# Altium schematic symbol library Connectors_Misc.SchLib: 48 symbols (part 1 of 2)
Pins are listed as number, name and electrical type; pins without a type are passive.

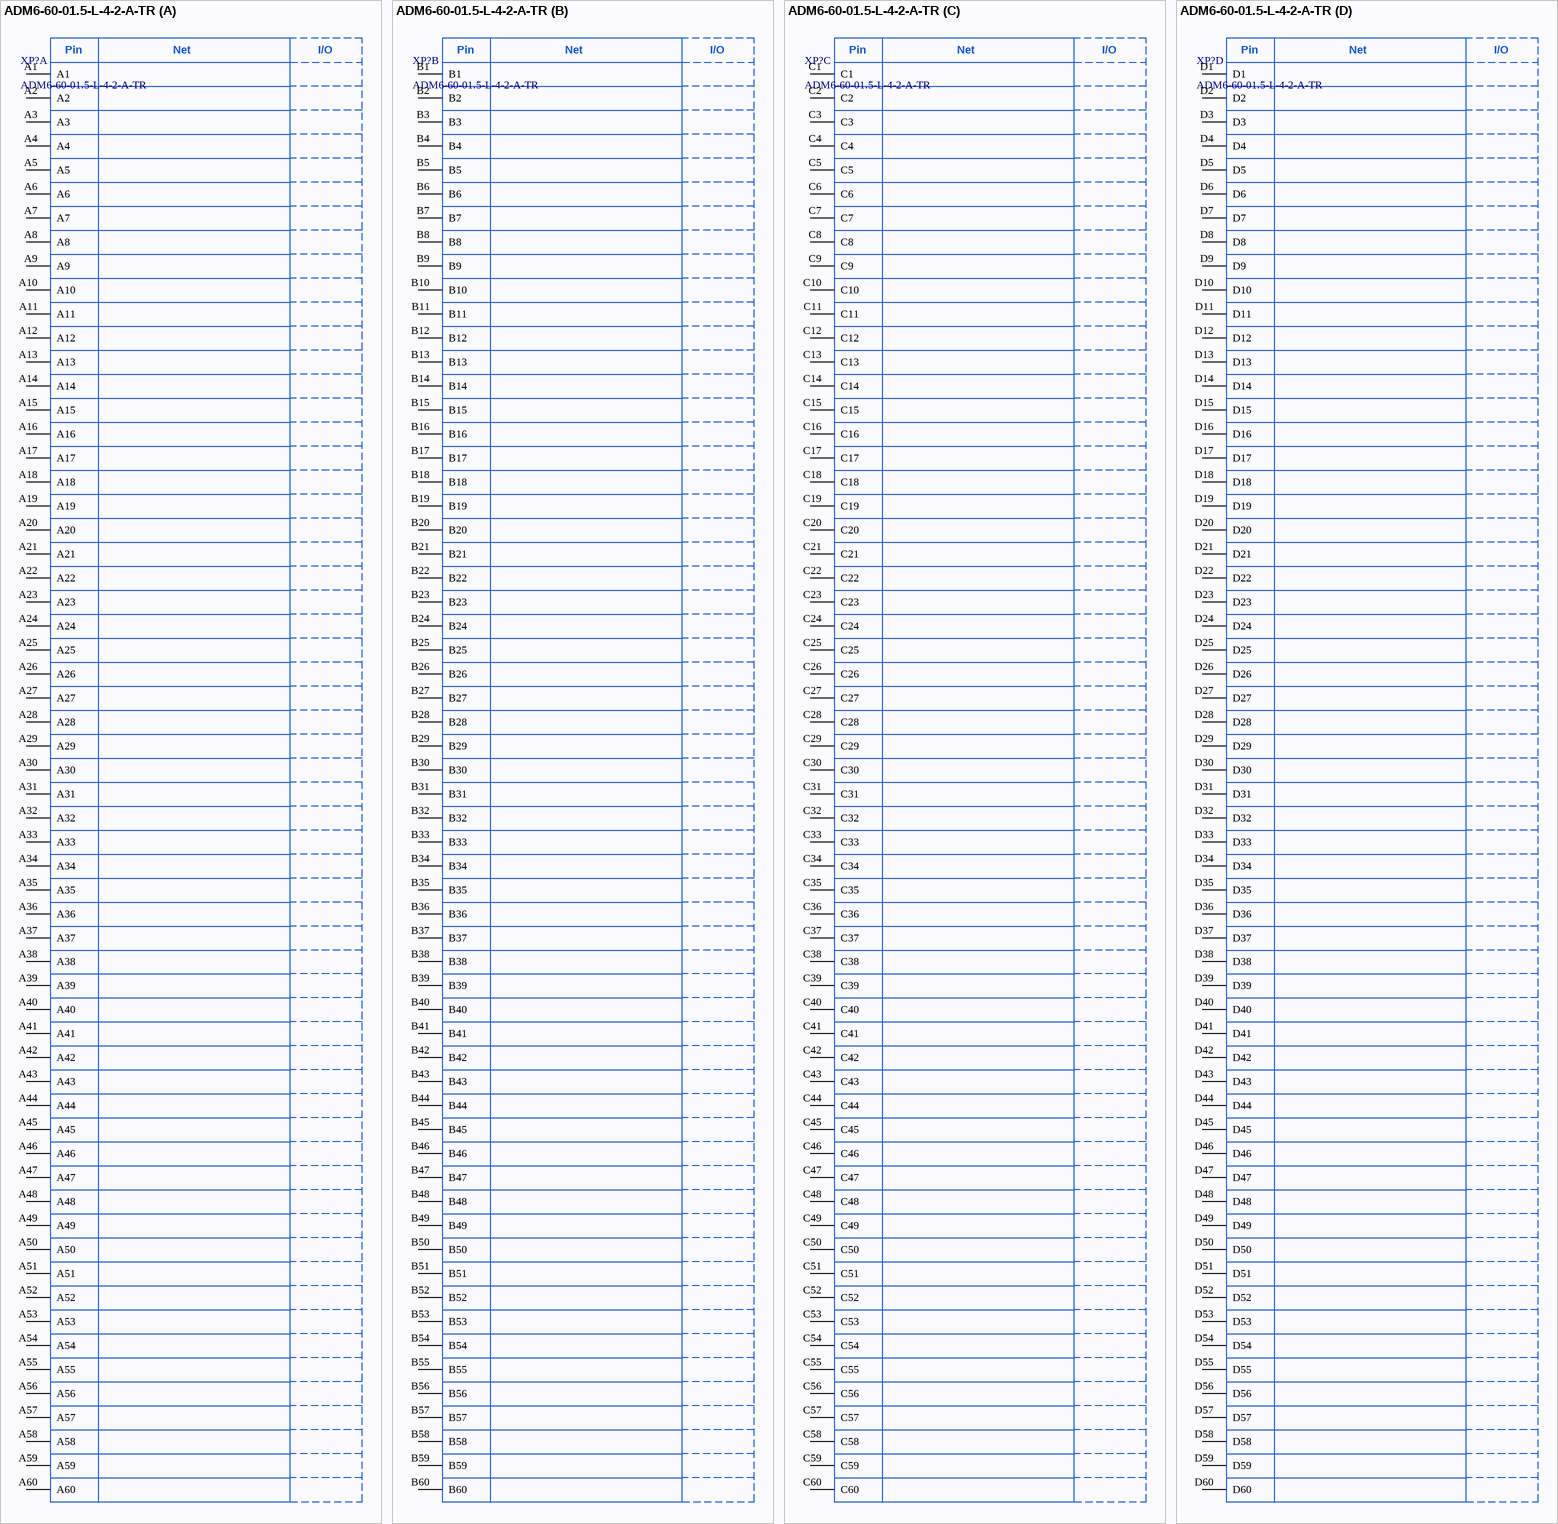
[diagram p0: symbol ADM6-60-01.5-L-4-2-A-TR]

## ADM6-60-01.5-L-4-2-A-TR
designator XP?
0.635 mm AcceleRate HD High-Density 4-Row Terminal; Manufacturer: Samtec; ItemType: Connector; PartNumber: ADM6-60-01.5-L-4-2-A-TR; ItemSubType: AcceleRate; Mounting: SMD
footprint ADM6-60-01.5-L-4-2-A-TR (0.635 mm AcceleRate HD High-Density 4-Row Terminal)
part A pins: A1, A2, A3, A4, A5, A6, A7, A8, A9, A10, A11, A12, A13, A14, A15, A16, A17, A18, A19, A20, A21, A22, A23, A24, A25, A26, A27, A28, A29, A30, A31, A32, A33, A34, A35, A36, A37, A38, A39, A40, A41, A42, A43, A44, A45, A46, A47, A48, A49, A50, A51, A52, A53, A54, A55, A56, A57, A58, A59, A60
part B pins: B1, B2, B3, B4, B5, B6, B7, B8, B9, B10, B11, B12, B13, B14, B15, B16, B17, B18, B19, B20, B21, B22, B23, B24, B25, B26, B27, B28, B29, B30, B31, B32, B33, B34, B35, B36, B37, B38, B39, B40, B41, B42, B43, B44, B45, B46, B47, B48, B49, B50, B51, B52, B53, B54, B55, B56, B57, B58, B59, B60
part C pins: C1, C2, C3, C4, C5, C6, C7, C8, C9, C10, C11, C12, C13, C14, C15, C16, C17, C18, C19, C20, C21, C22, C23, C24, C25, C26, C27, C28, C29, C30, C31, C32, C33, C34, C35, C36, C37, C38, C39, C40, C41, C42, C43, C44, C45, C46, C47, C48, C49, C50, C51, C52, C53, C54, C55, C56, C57, C58, C59, C60
part D pins: D1, D2, D3, D4, D5, D6, D7, D8, D9, D10, D11, D12, D13, D14, D15, D16, D17, D18, D19, D20, D21, D22, D23, D24, D25, D26, D27, D28, D29, D30, D31, D32, D33, D34, D35, D36, D37, D38, D39, D40, D41, D42, D43, D44, D45, D46, D47, D48, D49, D50, D51, D52, D53, D54, D55, D56, D57, D58, D59, D60
part A text: Pin; Net; I/O
part B text: Pin; Net; I/O
part C text: Pin; Net; I/O
part D text: Pin; Net; I/O

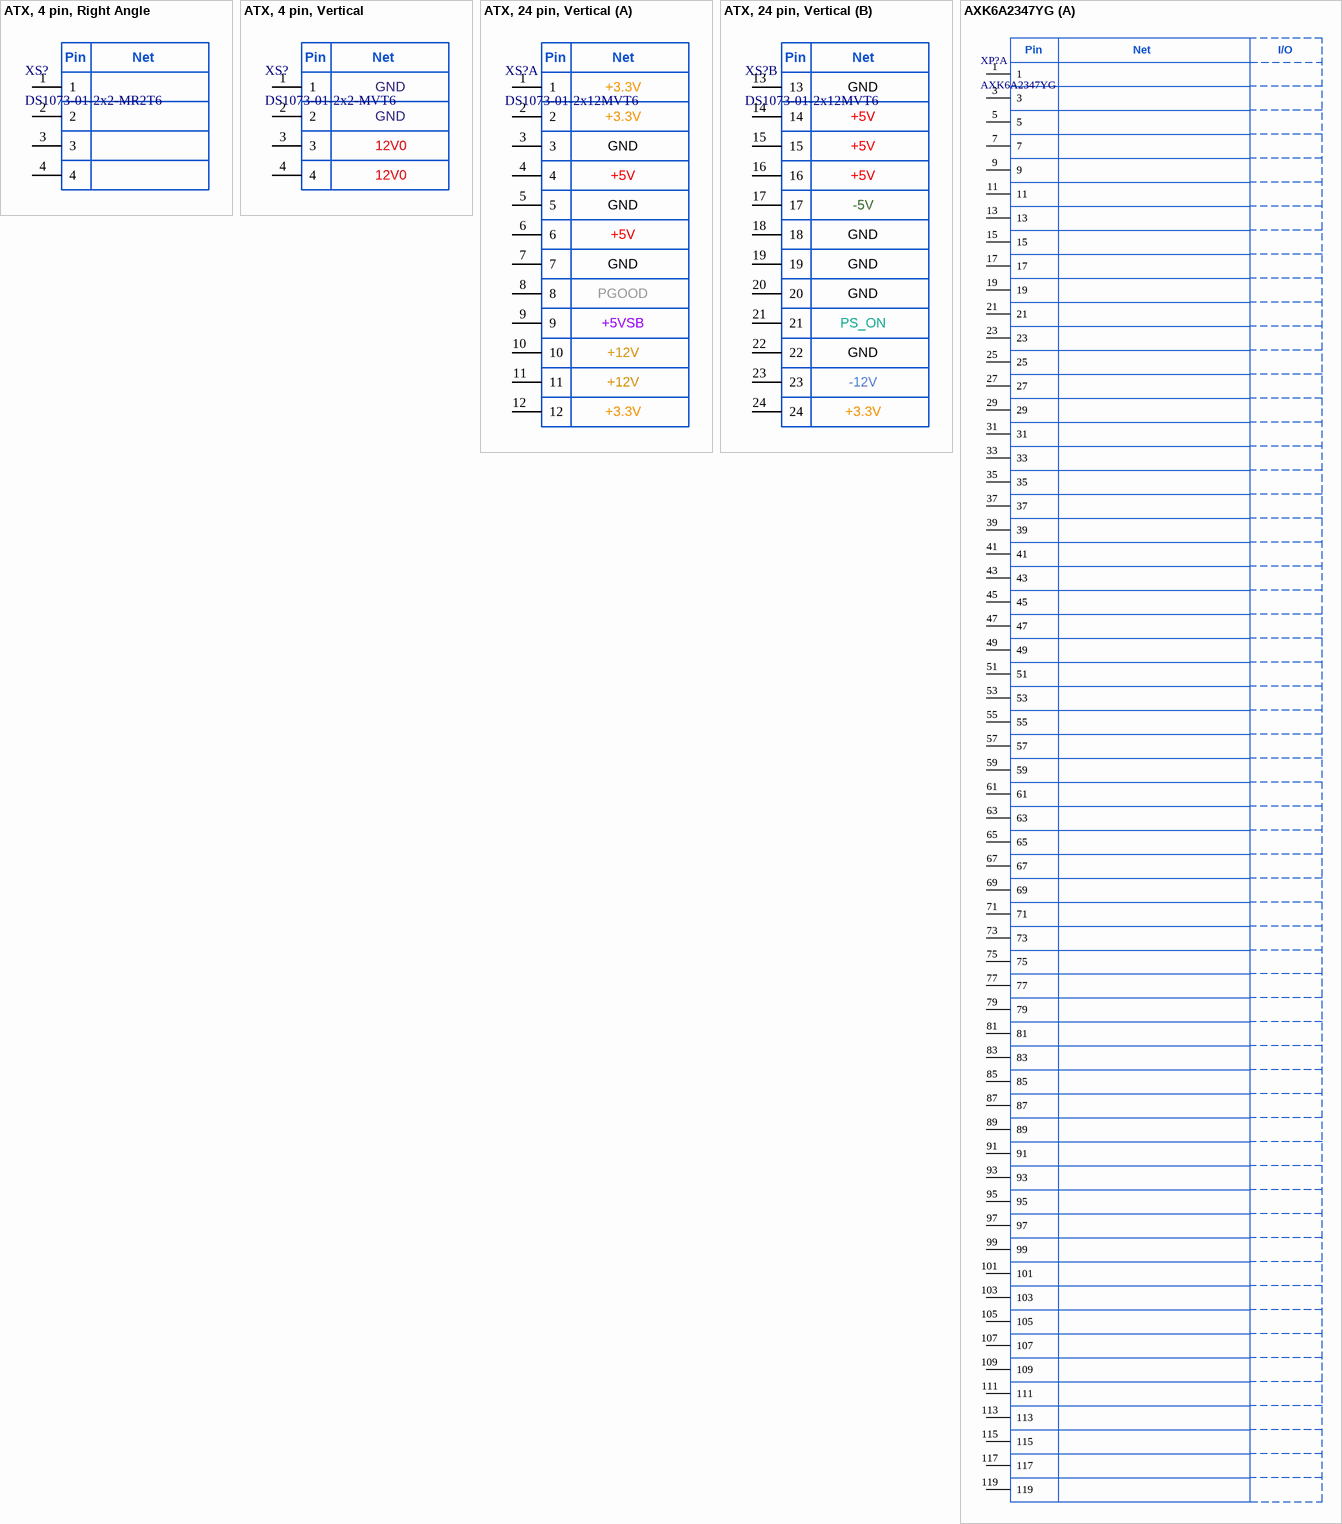
[diagram p1: symbols ATX, 4 pin, Right Angle to AXK6A2347YG]

## ATX, 4 pin, Right Angle
designator XS?, comment DS1073-01-2x2-MR2T6
ATX 4 pin right angle; Manufacturer: Connfly; ItemType: Connector; ItemSubType: ATX R/A; PartNumber: DS1073-01-2x2-MR2T6; Mounting: THT
footprint DS1073-01-2x2-MR2T6
pins: 1, 2, 3, 4
text: Pin; Net

## ATX, 4 pin, Vertical
designator XS?, comment DS1073-01-2x2-MVT6
ATX 4 pin; Manufacturer: Connfly; AltManufacturer1: KLS; ItemType: Connector; ItemSubType: ATX V/T; Alternative1: L-KLS1-4.20-2X02-SB; PartNumber: DS1073-01-2x2-MVT6; Mounting: THT
footprint DS1073-01-2x2-MVT6
pins: 1, 2, 3, 4
text: Pin; Net; GND; 12V0

## ATX, 24 pin, Vertical
designator XS?, comment DS1073-01-2x12MVT6
ATX 24 pin; Manufacturer: Connfly; ItemType: Connector; ItemSubType: ATX V/T; PartNumber: DS1073-01-2x12MVT6; Mounting: THT
footprint DS1073-01-2x12MVT6 (ATX24)
part A pins: 1, 2, 3, 4, 5, 6, 7, 8, 9, 10, 11, 12
part B pins: 13, 14, 15, 16, 17, 18, 19, 20, 21, 22, 23, 24
part A text: Pin; Net; +3.3V; GND; +5V; PGOOD; +5VSB; +12V
part B text: Pin; Net; GND; +5V; -5V; PS_ON; -12V; +3.3V

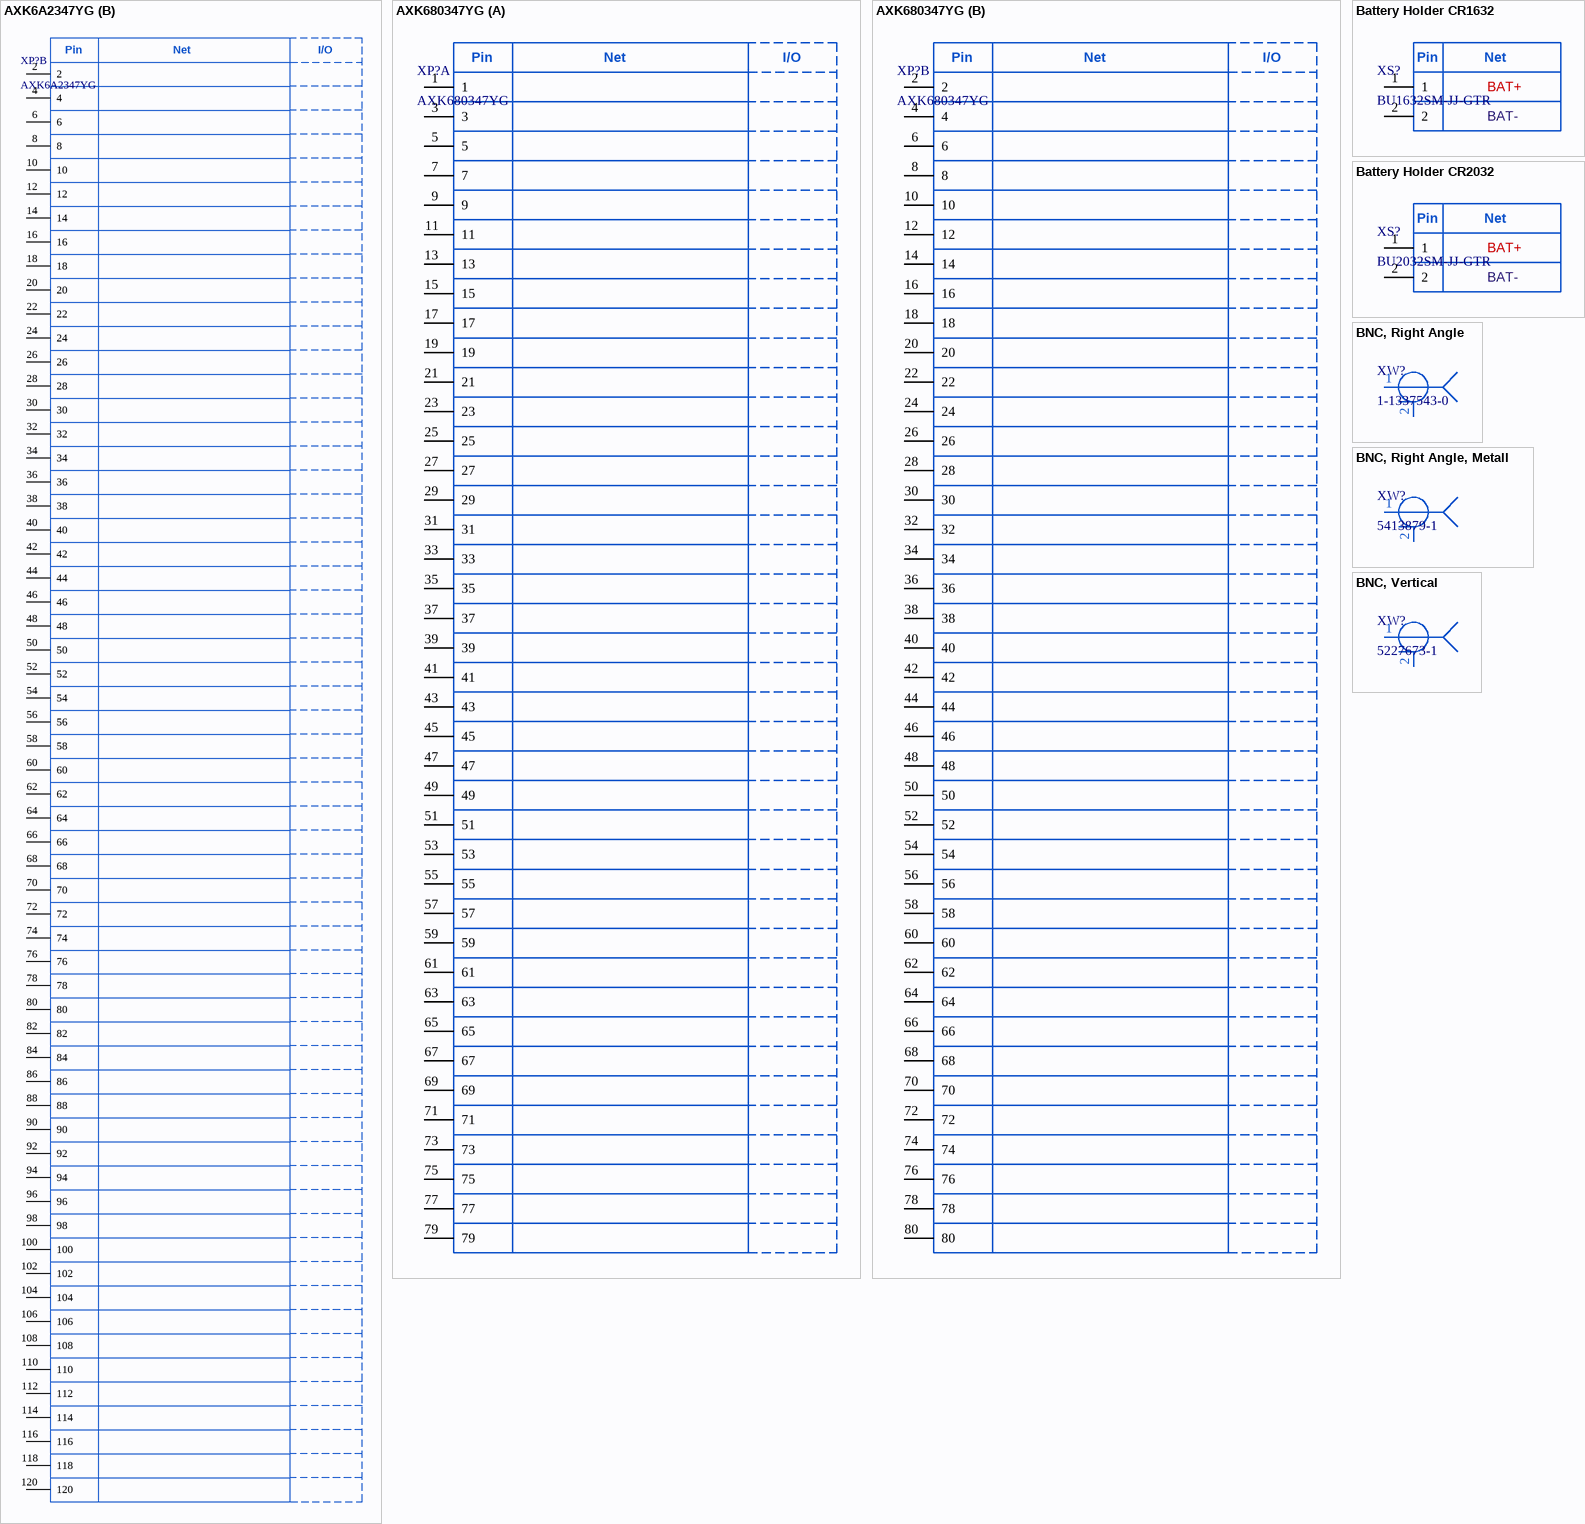
[diagram p2: symbols AXK6A2347YG to BNC, Vertical]

## AXK6A2347YG
designator XP?
0.5mm Pitch, 120-pin High-Speed connector for Board-to-Board connection, H = 3.0mm; Manufacturer: Panasonic; ItemSubType: P5K Series; PartNumber: AXK6A2347YG; ItemType: Connector; Mounting: SMD
footprint AXK6A2347YG (Header 120 pin)
part A pins: 1, 3, 5, 7, 9, 11, 13, 15, 17, 19, 21, 23, 25, 27, 29, 31, 33, 35, 37, 39, 41, 43, 45, 47, 49, 51, 53, 55, 57, 59, 61, 63, 65, 67, 69, 71, 73, 75, 77, 79, 81, 83, 85, 87, 89, 91, 93, 95, 97, 99, 101, 103, 105, 107, 109, 111, 113, 115, 117, 119
part B pins: 2, 4, 6, 8, 10, 12, 14, 16, 18, 20, 22, 24, 26, 28, 30, 32, 34, 36, 38, 40, 42, 44, 46, 48, 50, 52, 54, 56, 58, 60, 62, 64, 66, 68, 70, 72, 74, 76, 78, 80, 82, 84, 86, 88, 90, 92, 94, 96, 98, 100, 102, 104, 106, 108, 110, 112, 114, 116, 118, 120
part A text: Pin; Net; I/O
part B text: Pin; Net; I/O

## AXK680347YG
designator XP?
0.5mm Pitch, 80-pin High-Speed connector for Board-to-Board connection, H = 3.0mm; Manufacturer: Panasonic; ItemSubType: P5K Series; PartNumber: AXK680347YG; ItemType: Connector; Mounting: SMD
footprint AXK680347YG (Header 80 pin)
part A pins: 1, 3, 5, 7, 9, 11, 13, 15, 17, 19, 21, 23, 25, 27, 29, 31, 33, 35, 37, 39, 41, 43, 45, 47, 49, 51, 53, 55, 57, 59, 61, 63, 65, 67, 69, 71, 73, 75, 77, 79
part B pins: 2, 4, 6, 8, 10, 12, 14, 16, 18, 20, 22, 24, 26, 28, 30, 32, 34, 36, 38, 40, 42, 44, 46, 48, 50, 52, 54, 56, 58, 60, 62, 64, 66, 68, 70, 72, 74, 76, 78, 80
part A text: Pin; Net; I/O
part B text: Pin; Net; I/O

## Battery Holder CR1632
designator XS?, comment BU1632SM-JJ-GTR
CR1632 Holder; Manufacturer: Memory Protection Devices; ItemType: Connector; PartNumber: BU1632SM-JJ-GTR; ItemSubType: Holder; Mounting: SMD
footprint BU1632SM (CR1632 Holder)
pins: 1, 2
text: Pin; Net; BAT+; BAT-

## Battery Holder CR2032
designator XS?, comment BU2032SM-JJ-GTR
CR2032 Holder; Manufacturer: Memory Protection Devices; ItemType: Connector; PartNumber: BU2032SM-JJ-GTR; ItemSubType: Holder; Mounting: SMD
footprint BU2032SM (CR0232 Holder)
pins: 1, 2
text: Pin; Net; BAT+; BAT-

## BNC, Right Angle
designator XW?, comment 1-1337543-0
BNC R/A Socket; Manufacturer: TE-Connectivity; Impedance: 50; ItemType: Connector; PartNumber: 1-1337543-0; ItemSubType: BNC; Mounting: THT
footprint 1-1337543-0 (BNC Connector)
pins: 1, 2

## BNC, Right Angle, Metall
designator XW?, comment 5413879-1
BNC R/A Socket; Manufacturer: TE-Connectivity; Impedance: 50; ItemType: Connector; PartNumber: 5413879-1; ItemSubType: BNC; Mounting: THT
footprint 5413879-1 (BNC Connector)
pins: 1, 2

## BNC, Vertical
designator XW?, comment 5227673-1
BNC Vertical Socket; Manufacturer: TE-Connectivity; Impedance: 50; ItemType: Connector; PartNumber: 5227673-1; ItemSubType: BNC; Mounting: THT
footprint 5227673-1 (BNC Connector)
pins: 1, 2

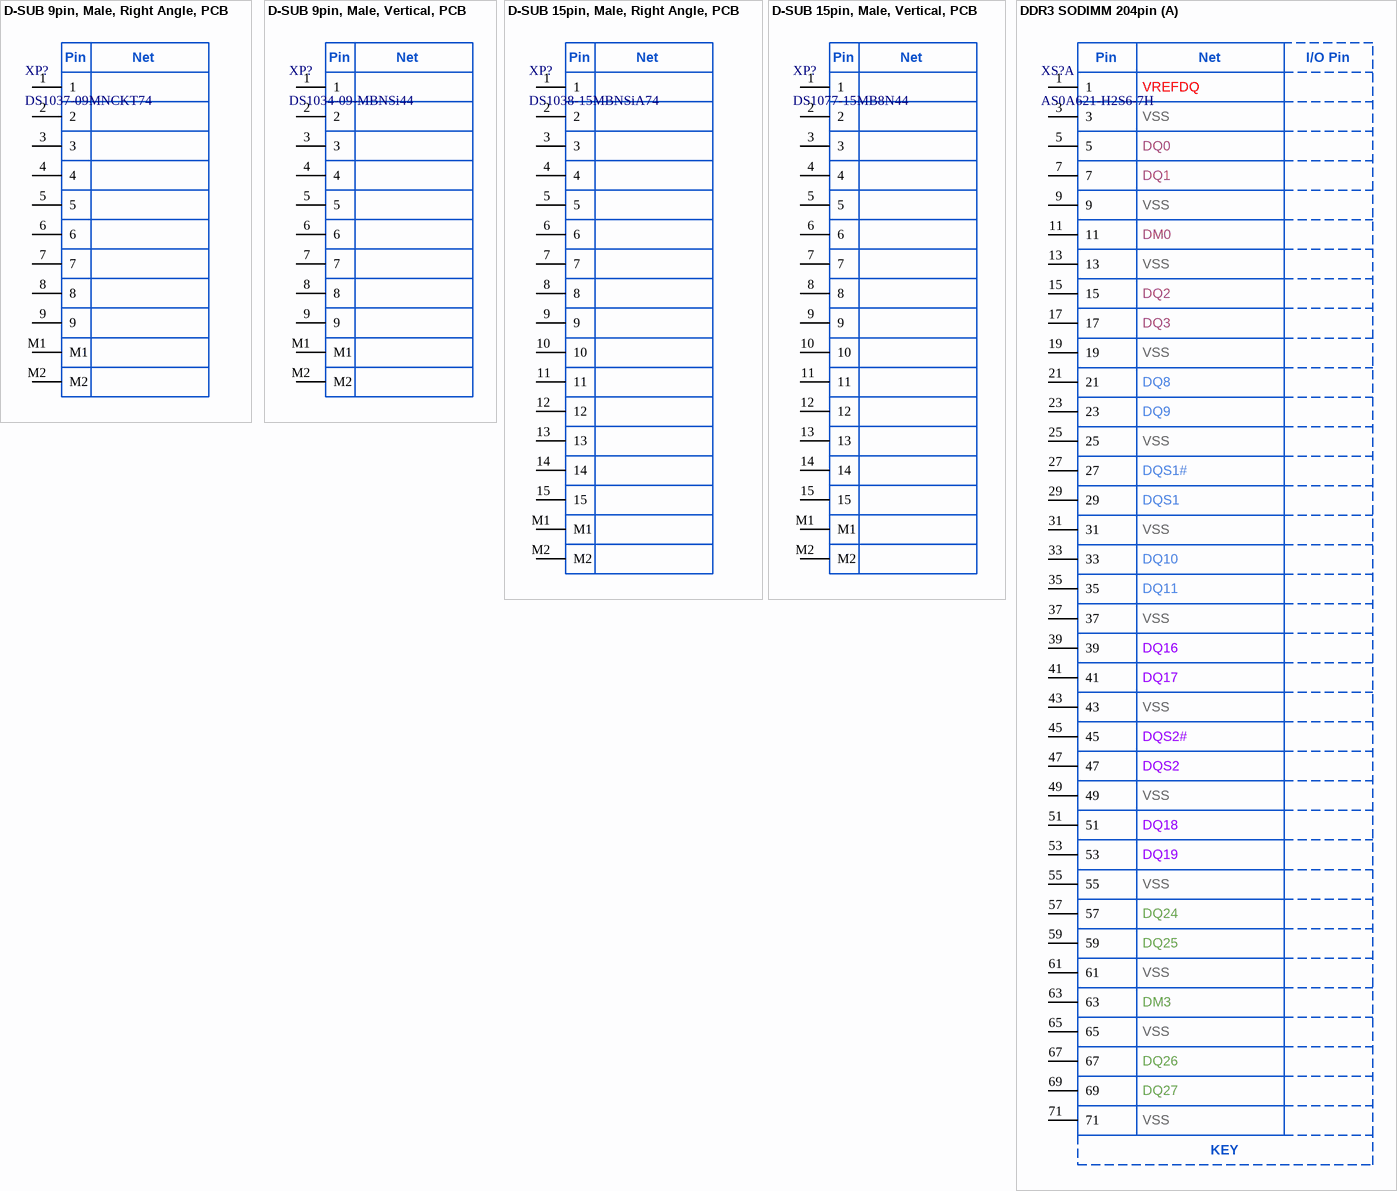
[diagram p3: symbols D-SUB 9pin, Male, Right Angle, PCB to DDR3 SODIMM 204pin]

## D-SUB 9pin, Male, Right Angle, PCB
designator XP?, comment DS1037-09MNCKT74
D-SUB 9pin, Male, Right Angle, PCB; Manufacturer: Connfly; ItemType: Connector; PartNumber: DS1037-09MNCKT74; ItemSubType: D-SUB; Mounting: THT
footprint DS1037-09MNCKT74 (D-SUB 9 pin with screw, right angle, 7.2mm)
pins: 1, 2, 3, 4, 5, 6, 7, 8, 9, M1, M2
text: Pin; Net

## D-SUB 9pin, Male, Vertical, PCB
designator XP?, comment DS1034-09-MBNSi44
D-SUB 9pin, Male, Vertical, PCB; Manufacturer: Connfly; ItemType: Connector; PartNumber: DS1034-09-MBNSi44; ItemSubType: D-SUB; Mounting: THT
footprint DS1034-09-MBNSi44 (D-SUB 9 pin with screw)
pins: 1, 2, 3, 4, 5, 6, 7, 8, 9, M1, M2
text: Pin; Net

## D-SUB 15pin, Male, Right Angle, PCB
designator XP?, comment DS1038-15MBNSiA74
D-SUB 15pin, Male, Right Angle, PCB, 3 row; Manufacturer: Connfly; ItemType: Connector; PartNumber: DS1038-15MBNSiA74; ItemSubType: D-SUB; Mounting: THT
footprint DS1038-15MBNSiA74 (D-SUB 15 pin with screw, right angle, 7.2mm)
pins: 1, 2, 3, 4, 5, 6, 7, 8, 9, 10, 11, 12, 13, 14, 15, M1, M2
text: Pin; Net

## D-SUB 15pin, Male, Vertical, PCB
designator XP?, comment DS1077-15MB8N44
D-SUB 15pin, Male, Vertical, PCB; Manufacturer: Connfly; ItemType: Connector; PartNumber: DS1077-15MB8N44; ItemSubType: D-SUB; Mounting: THT
footprint DS1077-15MB8N44 (D-SUB 15 pin with screw)
pins: 1, 2, 3, 4, 5, 6, 7, 8, 9, 10, 11, 12, 13, 14, 15, M1, M2
text: Pin; Net

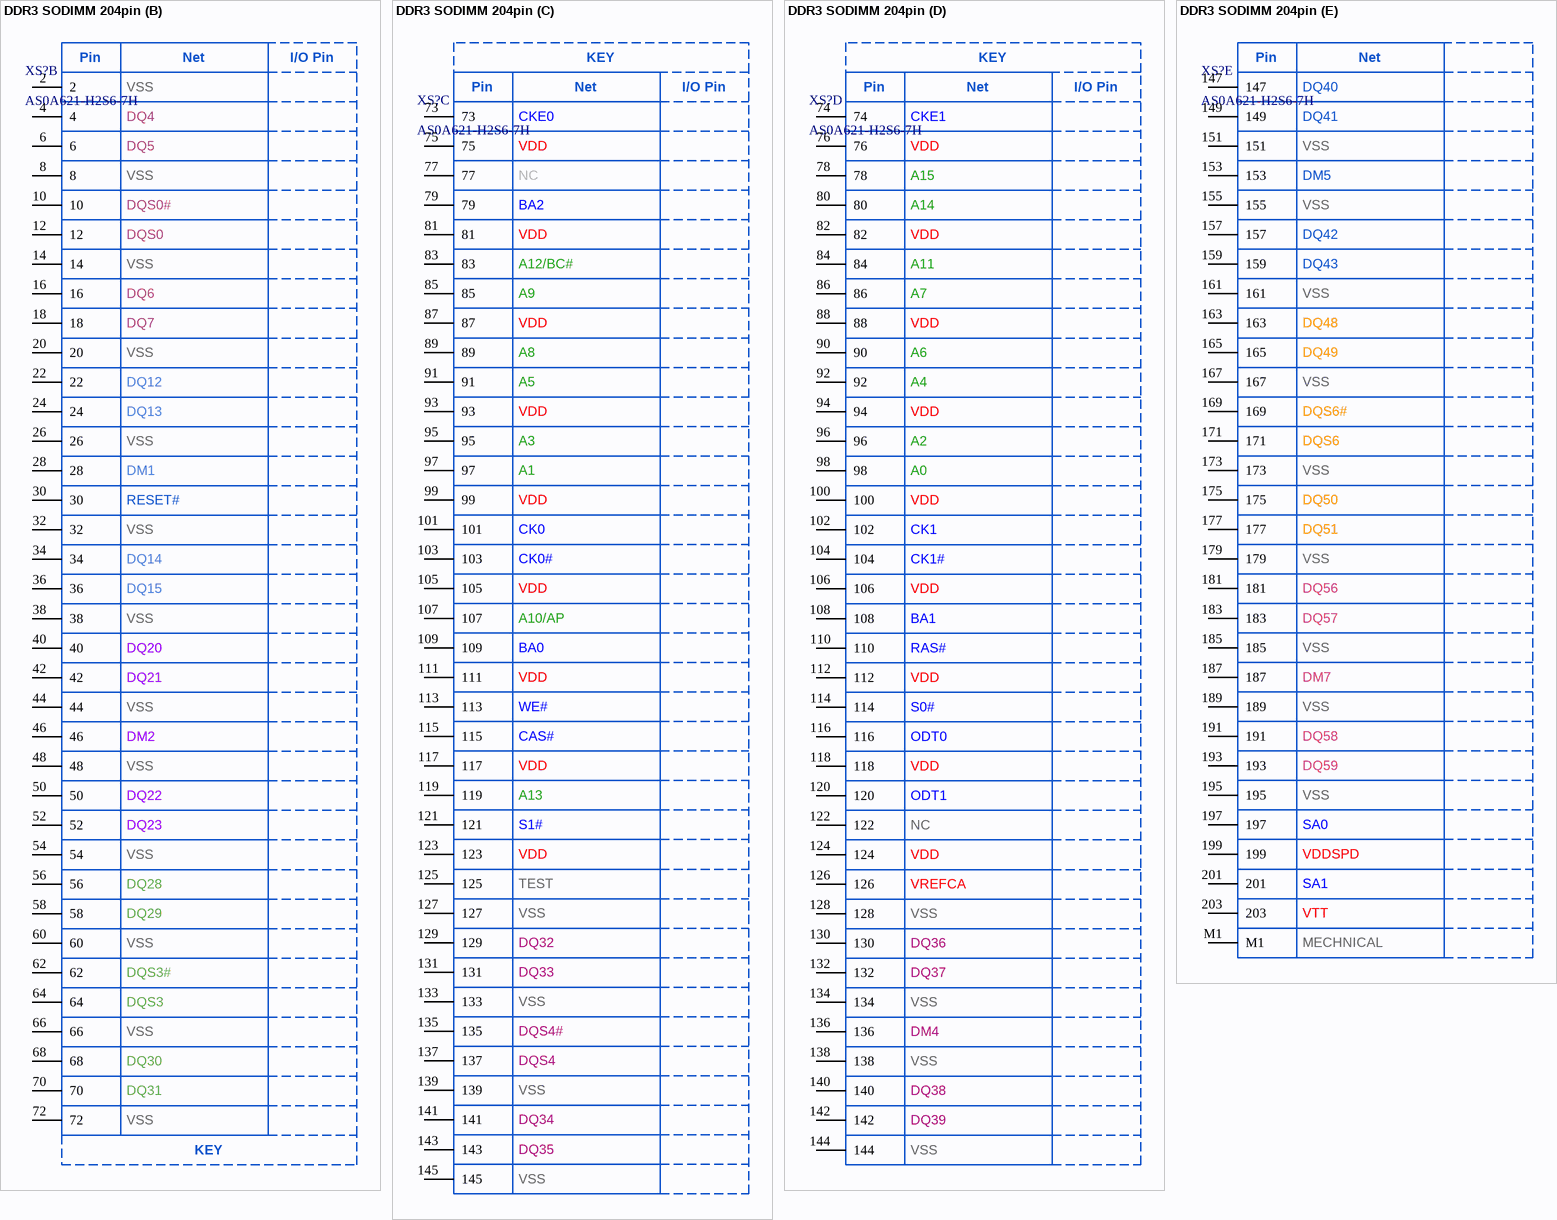
[diagram p4: symbol DDR3 SODIMM 204pin]

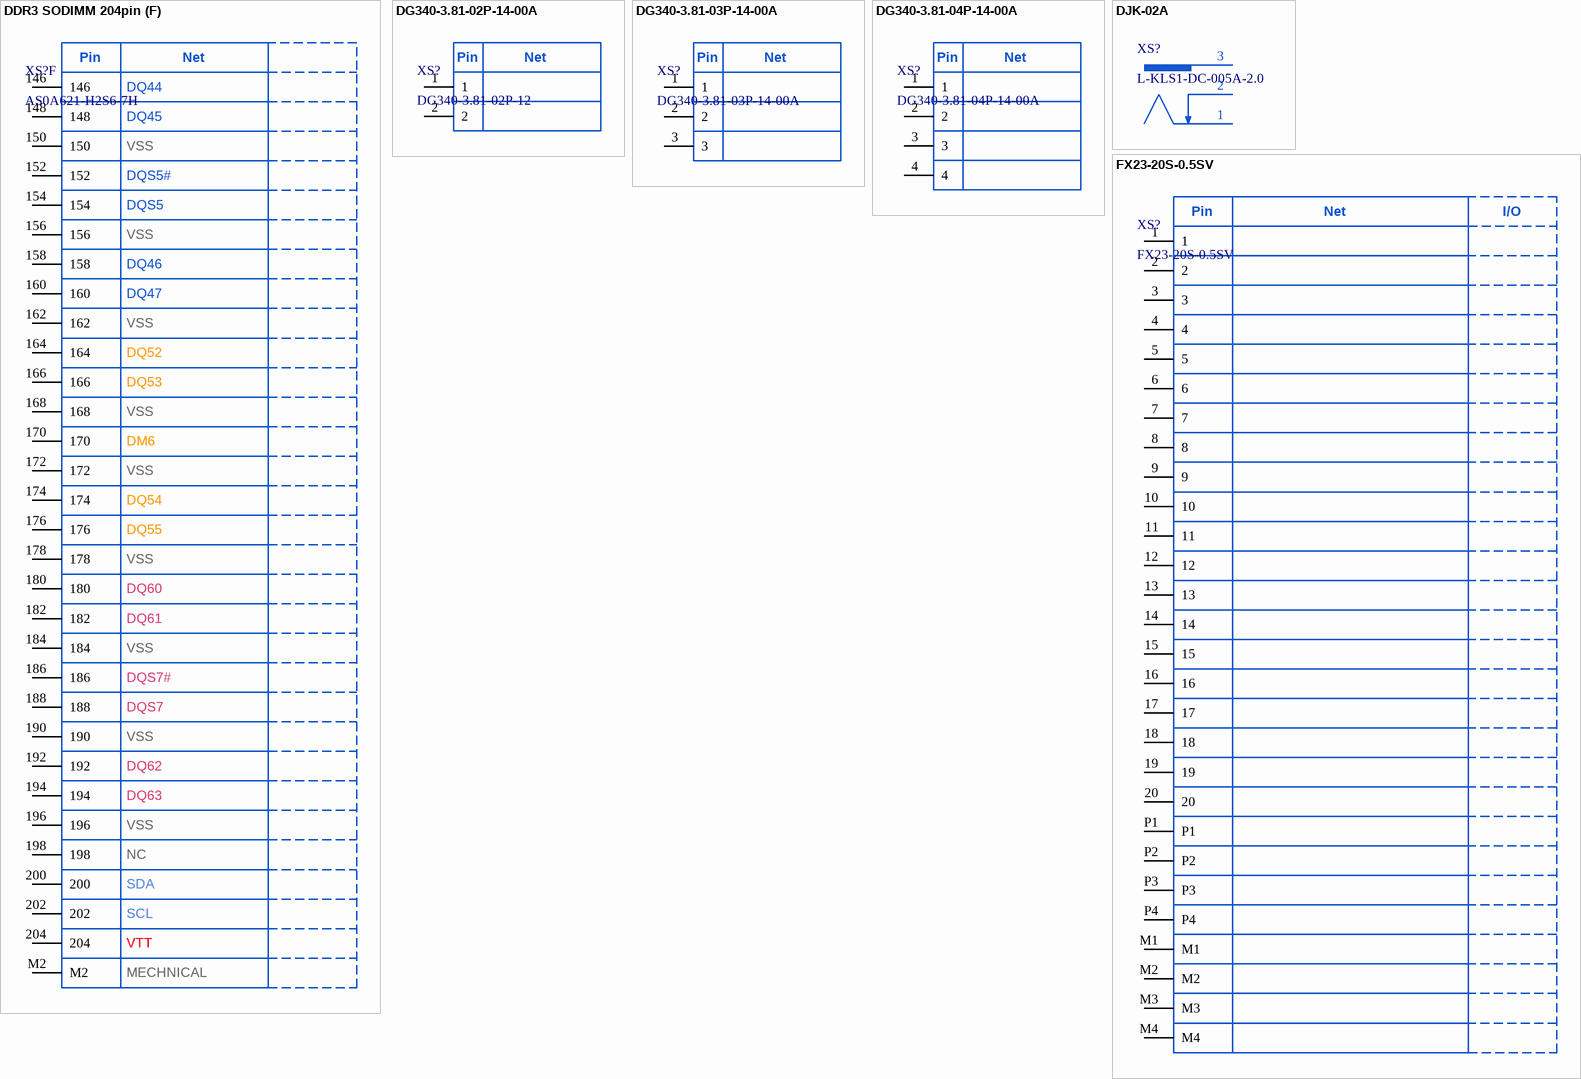
[diagram p5: symbols DDR3 SODIMM 204pin to FX23-20S-0.5SV]

## DDR3 SODIMM 204pin
designator XS?, comment AS0A621-H2S6-7H
204-pin SO DIMM DDR3 Socket; Manufacturer: Foxconn; ItemType: Connector; ItemSubType: SODIMM; PartNumber: AS0A621-H2S6-7H; Mounting: SMD
footprint AS0A621-H2S6-7H (204-pin SO DIMM DDR3 Socket)
part A pins: 1, 3, 5, 7, 9, 11, 13, 15, 17, 19, 21, 23, 25, 27, 29, 31, 33, 35, 37, 39, 41, 43, 45, 47, 49, 51, 53, 55, 57, 59, 61, 63, 65, 67, 69, 71
part B pins: 2, 4, 6, 8, 10, 12, 14, 16, 18, 20, 22, 24, 26, 28, 30, 32, 34, 36, 38, 40, 42, 44, 46, 48, 50, 52, 54, 56, 58, 60, 62, 64, 66, 68, 70, 72
part C pins: 73, 75, 77, 79, 81, 83, 85, 87, 89, 91, 93, 95, 97, 99, 101, 103, 105, 107, 109, 111, 113, 115, 117, 119, 121, 123, 125, 127, 129, 131, 133, 135, 137, 139, 141, 143, 145
part D pins: 74, 76, 78, 80, 82, 84, 86, 88, 90, 92, 94, 96, 98, 100, 102, 104, 106, 108, 110, 112, 114, 116, 118, 120, 122, 124, 126, 128, 130, 132, 134, 136, 138, 140, 142, 144
part E pins: 147, 149, 151, 153, 155, 157, 159, 161, 163, 165, 167, 169, 171, 173, 175, 177, 179, 181, 183, 185, 187, 189, 191, 193, 195, 197, 199, 201, 203, M1
part F pins: 146, 148, 150, 152, 154, 156, 158, 160, 162, 164, 166, 168, 170, 172, 174, 176, 178, 180, 182, 184, 186, 188, 190, 192, 194, 196, 198, 200, 202, 204, M2
part A text: Pin; Net; I/O Pin; VREFDQ; VSS; DQ0; DQ1; DM0; DQ2; DQ3; DQ8; DQ9; DQS1#; DQS1; DQ10; DQ11; DQ16; DQ17; DQS2#; DQS2; DQ18; DQ19; DQ24; DQ25; DM3; DQ26; DQ27; KEY
part B text: Pin; Net; I/O Pin; VSS; DQ4; DQ5; DQS0#; DQS0; DQ6; DQ7; DQ12; DQ13; DM1; RESET#; DQ14; DQ15; DQ20; DQ21; DM2; DQ22; DQ23; DQ28; DQ29; DQS3#; DQS3; DQ30; DQ31; KEY
part C text: KEY; Pin; Net; I/O Pin; CKE0; VDD; NC; BA2; A12/BC#; A9; A8; A5; A3; A1; CK0; CK0#; A10/AP; BA0; WE#; CAS#; A13; S1#; TEST; VSS; DQ32; DQ33; DQS4#; DQS4; DQ34; DQ35
part D text: KEY; Pin; Net; I/O Pin; CKE1; VDD; A15; A14; A11; A7; A6; A4; A2; A0; CK1; CK1#; BA1; RAS#; S0#; ODT0; ODT1; NC; VREFCA; VSS; DQ36; DQ37; DM4; DQ38; DQ39
part E text: Pin; Net; DQ40; DQ41; VSS; DM5; DQ42; DQ43; DQ48; DQ49; DQS6#; DQS6; DQ50; DQ51; DQ56; DQ57; DM7; DQ58; DQ59; SA0; VDDSPD; SA1; VTT; MECHNICAL
part F text: Pin; Net; DQ44; DQ45; VSS; DQS5#; DQS5; DQ46; DQ47; DQ52; DQ53; DM6; DQ54; DQ55; DQ60; DQ61; DQS7#; DQS7; DQ62; DQ63; NC; SDA; SCL; VTT; MECHNICAL

## DG340-3.81-02P-14-00A
designator XS?, comment DG340-3.81-02P-12
2-way screw terminal, pitch 150mils (3.81mm); Manufacturer: DEGSON; ItemType: Connector; PartNumber: DG340-3.81-02P-12; ItemSubType: Screw Terminal; Mounting: THT
footprint DG340-3.81-02P (2-way screw terminal, pitch 150mils (3.81mm))
pins: 1, 2
text: Pin; Net

## DG340-3.81-03P-14-00A
designator XS?
3-way screw terminal, pitch 150mils (3.81mm); Manufacturer: DEGSON; ItemType: Connector; PartNumber: DG340-3.81-03P-14-00A; ItemSubType: Screw Terminal; Mounting: THT
footprint DG340-3.81-03P (3-way screw terminal, pitch 150mils (3.81mm))
pins: 1, 2, 3
text: Pin; Net

## DG340-3.81-04P-14-00A
designator XS?
4-way screw terminal, pitch 150mils (3.81mm); Manufacturer: DEGSON; ItemType: Connector; PartNumber: DG340-3.81-04P-14-00A; ItemSubType: Screw Terminal; Mounting: THT
footprint DG340-3.81-04P (4-way screw terminal, pitch 150mils (3.81mm))
pins: 1, 2, 3, 4
text: Pin; Net

## DJK-02A
designator XS?, comment L-KLS1-DC-005A-2.0
DC Jack Connector 2.0 х 9 mm; Manufacturer: KLS; ItemSubType: Power Jack; PartNumber: L-KLS1-DC-005A-2.0; ItemType: Connector; Mounting: THT
footprint DJK-02A
pins: 1, 2, 3

## FX23-20S-0.5SV
designator XS?
0.5mm Pitch, 20-pin High-Speed Socket Board-to-Board Floating Connectors; Manufacturer: Hirose; ItemSubType: FX23; PartNumber: FX23-20S-0.5SV; ItemType: Connector; Mounting: SMD
footprint FX23-20S-0.5SV (Socket 20 pin)
pins: 1, 2, 3, 4, 5, 6, 7, 8, 9, 10, 11, 12, 13, 14, 15, 16, 17, 18, 19, 20, M1, M2, M3, M4, P1, P2, P3, P4
text: Pin; Net; I/O

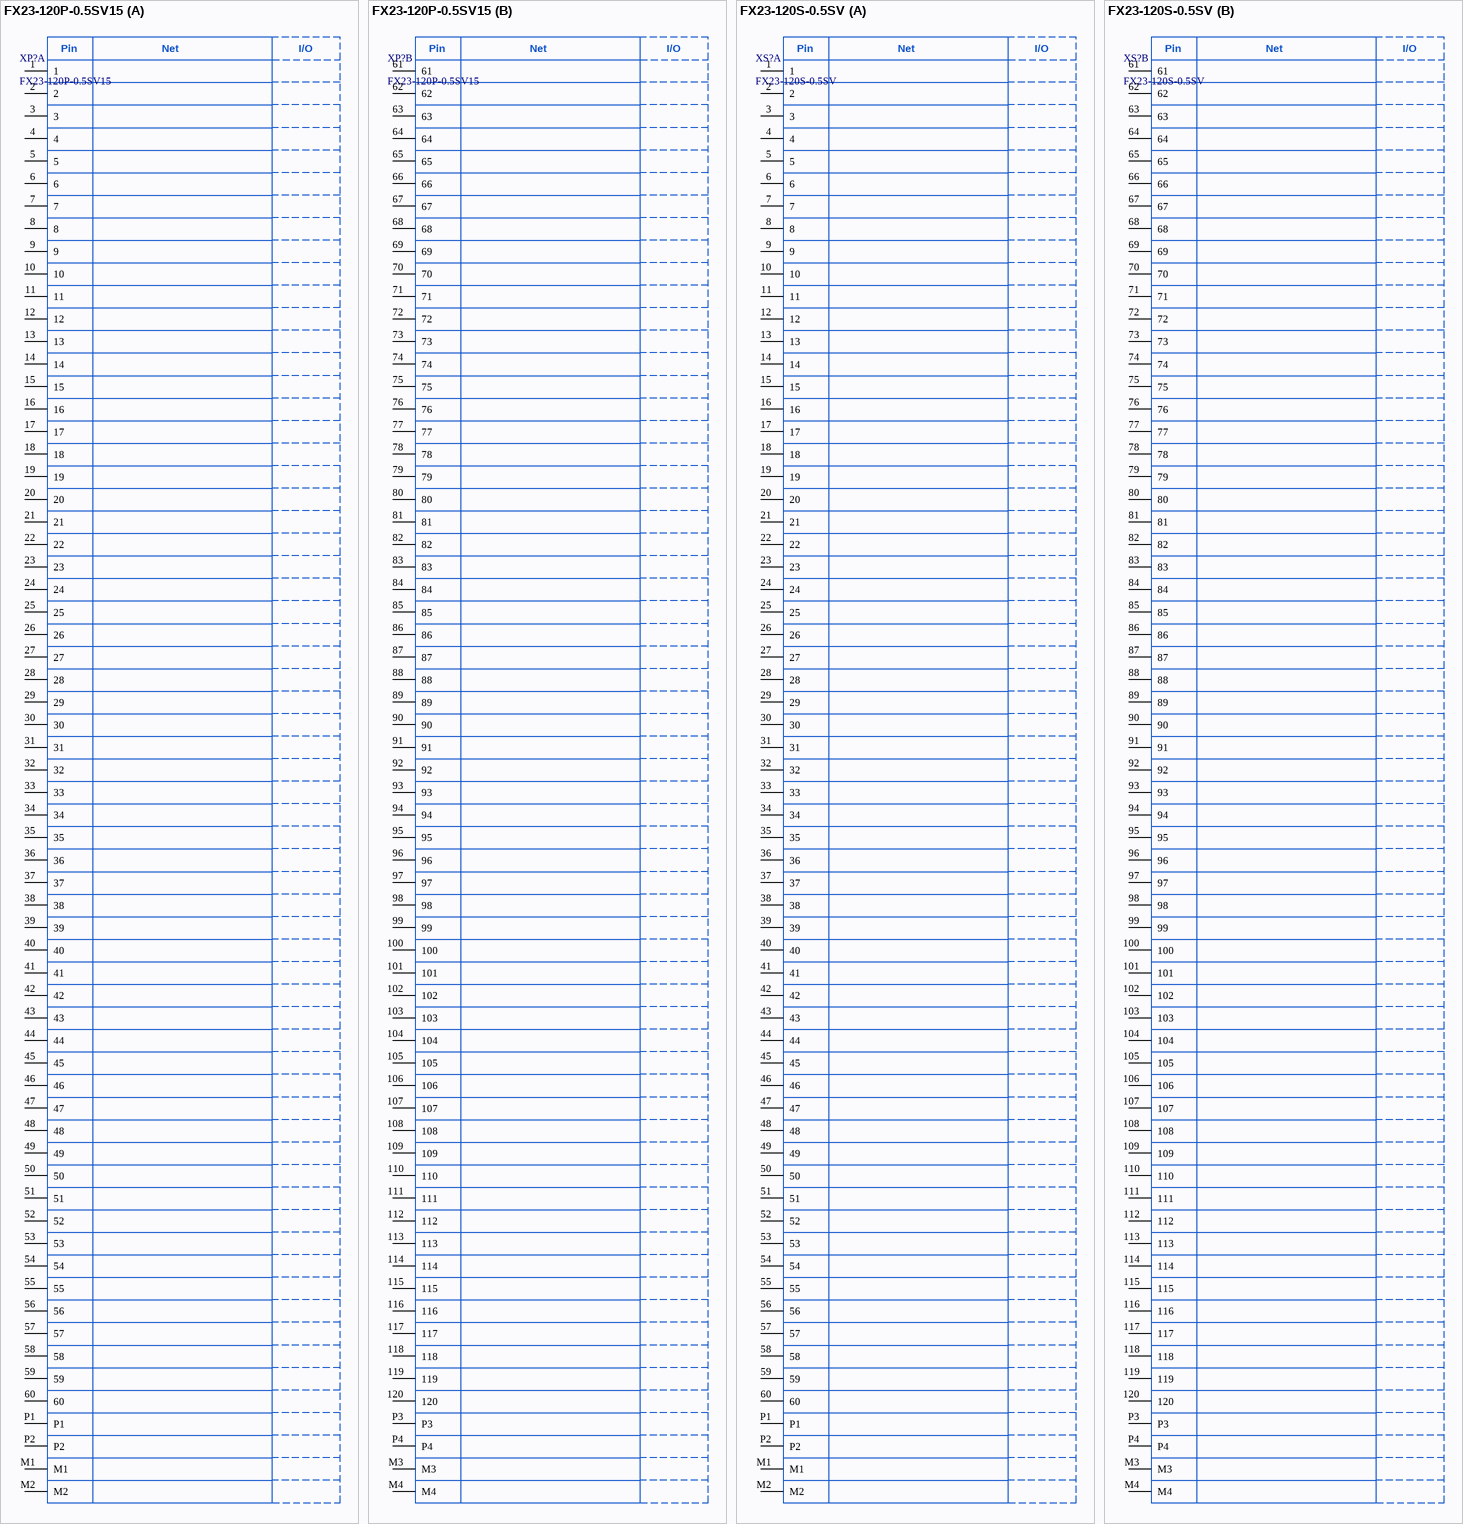
[diagram p6: symbols FX23-120P-0.5SV15 to FX23-120S-0.5SV]

## FX23-120P-0.5SV15
designator XP?
0.5mm Pitch, 120-pin High-Speed Terminal Board-to-Board Floating Connectors, H=15mm; Manufacturer: Hirose; ItemSubType: FX23; PartNumber: FX23-120P-0.5SV15; ItemType: Connector; Mounting: SMD
footprint FX23-120P-0.5SV15 (Terminal 120 pin)
part A pins: 1, 2, 3, 4, 5, 6, 7, 8, 9, 10, 11, 12, 13, 14, 15, 16, 17, 18, 19, 20, 21, 22, 23, 24, 25, 26, 27, 28, 29, 30, 31, 32, 33, 34, 35, 36, 37, 38, 39, 40, 41, 42, 43, 44, 45, 46, 47, 48, 49, 50, 51, 52, 53, 54, 55, 56, 57, 58, 59, 60, M1, M2, P1, P2
part B pins: 61, 62, 63, 64, 65, 66, 67, 68, 69, 70, 71, 72, 73, 74, 75, 76, 77, 78, 79, 80, 81, 82, 83, 84, 85, 86, 87, 88, 89, 90, 91, 92, 93, 94, 95, 96, 97, 98, 99, 100, 101, 102, 103, 104, 105, 106, 107, 108, 109, 110, 111, 112, 113, 114, 115, 116, 117, 118, 119, 120, M3, M4, P3, P4
part A text: Pin; Net; I/O
part B text: Pin; Net; I/O

## FX23-120S-0.5SV
designator XS?
0.5mm Pitch, 120-pin High-Speed Socket Board-to-Board Floating Connectors; Manufacturer: Hirose; ItemSubType: FX23; PartNumber: FX23-120S-0.5SV; ItemType: Connector; Mounting: SMD
footprint FX23-120S-0.5SV (Socket 120 pin)
part A pins: 1, 2, 3, 4, 5, 6, 7, 8, 9, 10, 11, 12, 13, 14, 15, 16, 17, 18, 19, 20, 21, 22, 23, 24, 25, 26, 27, 28, 29, 30, 31, 32, 33, 34, 35, 36, 37, 38, 39, 40, 41, 42, 43, 44, 45, 46, 47, 48, 49, 50, 51, 52, 53, 54, 55, 56, 57, 58, 59, 60, M1, M2, P1, P2
part B pins: 61, 62, 63, 64, 65, 66, 67, 68, 69, 70, 71, 72, 73, 74, 75, 76, 77, 78, 79, 80, 81, 82, 83, 84, 85, 86, 87, 88, 89, 90, 91, 92, 93, 94, 95, 96, 97, 98, 99, 100, 101, 102, 103, 104, 105, 106, 107, 108, 109, 110, 111, 112, 113, 114, 115, 116, 117, 118, 119, 120, M3, M4, P3, P4
part A text: Pin; Net; I/O
part B text: Pin; Net; I/O

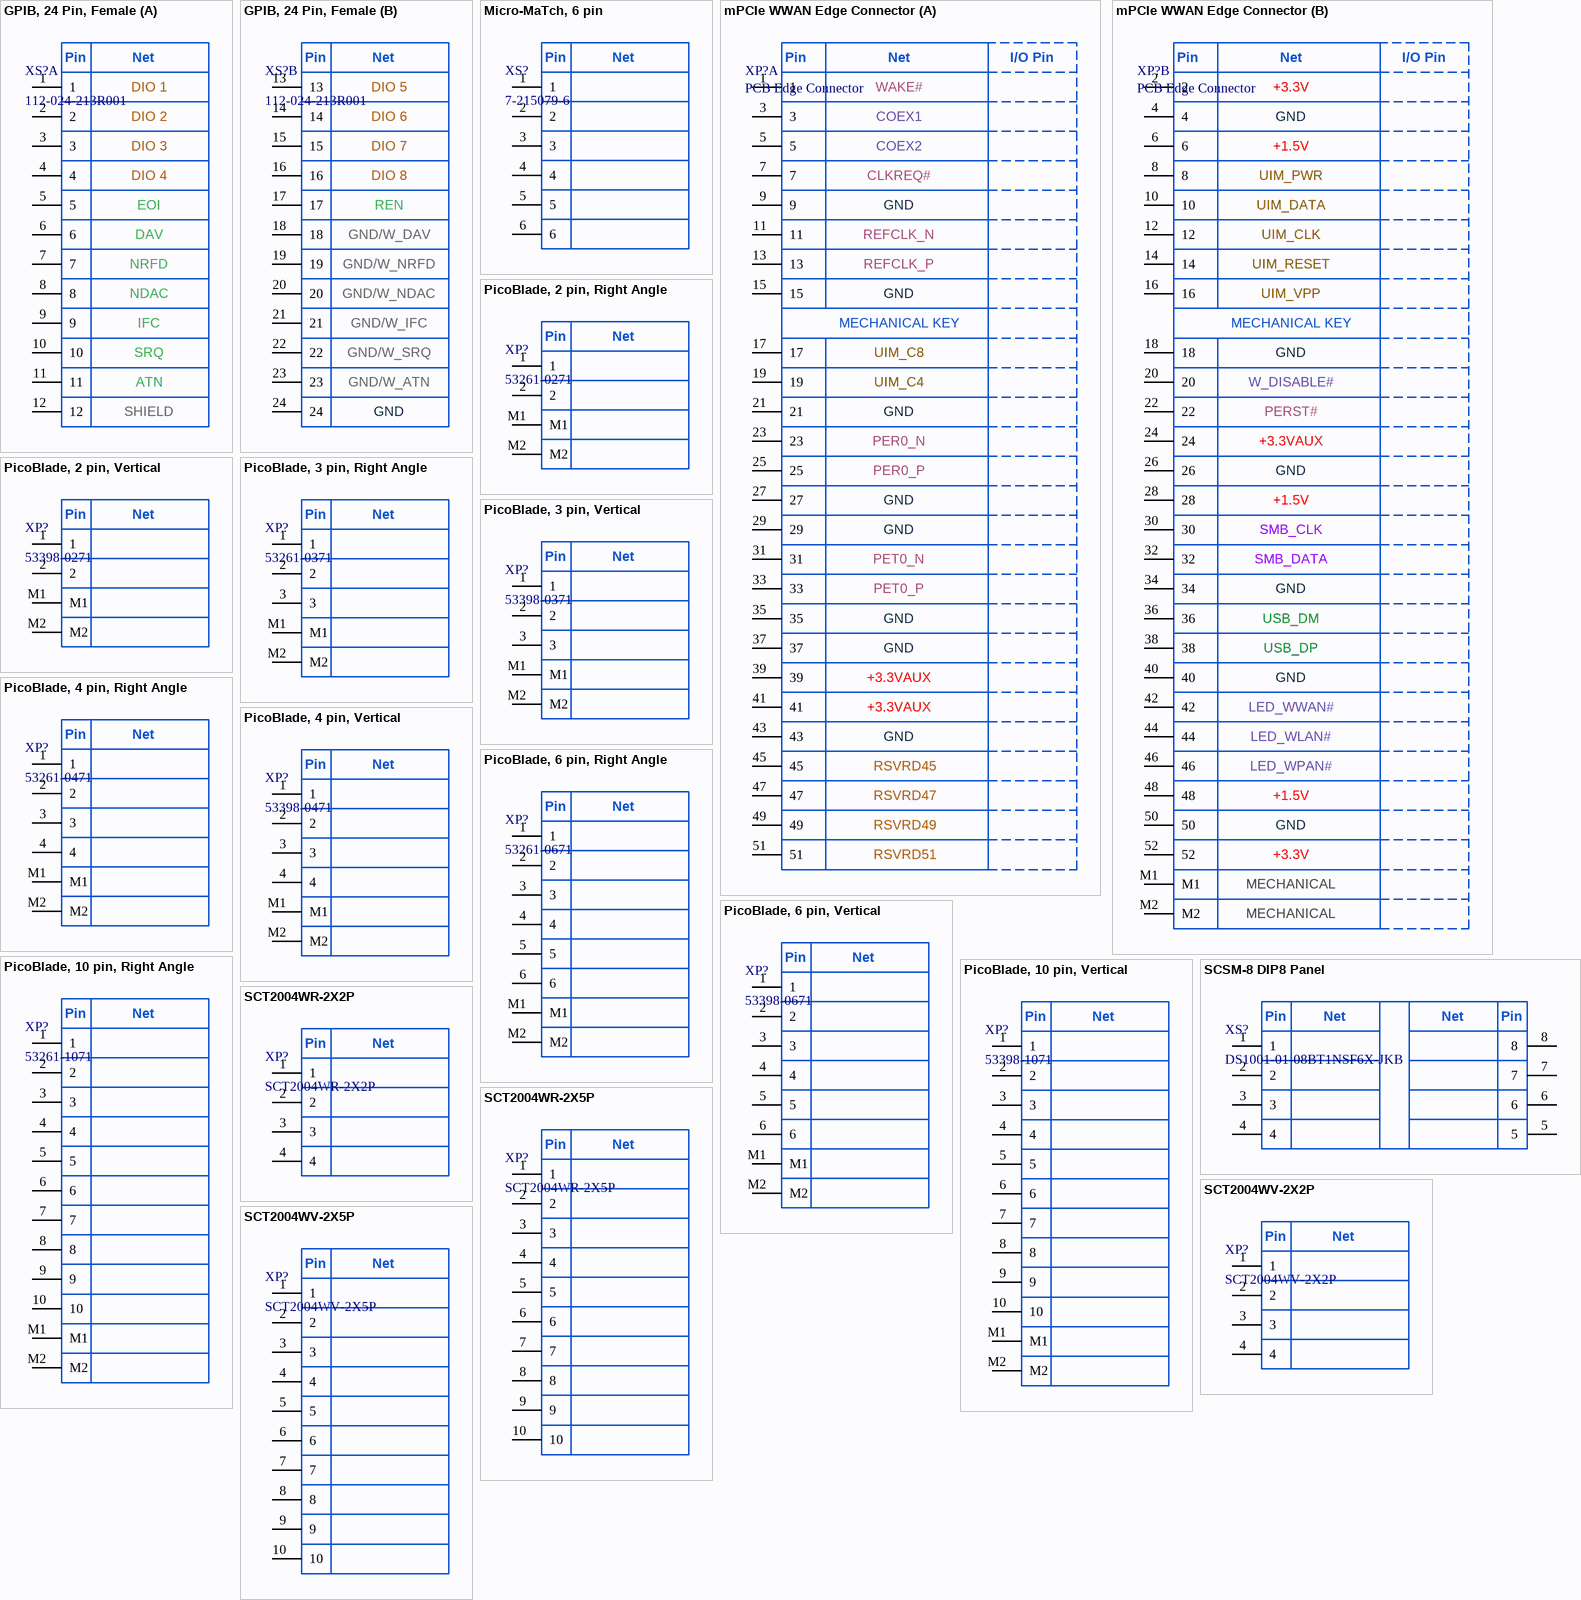
[diagram p7: symbols GPIB, 24 Pin, Female to SCT2004WV-2X5P]

## GPIB, 24 Pin, Female
designator XS?, comment 112-024-213R001
SCSI .085" Ribbon Connector GPIB (IEEE-488); Manufacturer: Norcomp; PartNumber: 112-024-213R001; ItemType: Connector; ItemSubType: GPIB; Mounting: THT
footprint 112-024-213R001 (SCSI .085" Ribbon Connector GPIB (IEEE-488))
part A pins: 1, 2, 3, 4, 5, 6, 7, 8, 9, 10, 11, 12
part B pins: 13, 14, 15, 16, 17, 18, 19, 20, 21, 22, 23, 24
part A text: Pin; Net; DIO 1; DIO 2; DIO 3; DIO 4; EOI; DAV; NRFD; NDAC; IFC; SRQ; ATN; SHIELD
part B text: Pin; Net; DIO 5; DIO 6; DIO 7; DIO 8; REN; GND/W_DAV; GND/W_NRFD; GND/W_NDAC; GND/W_IFC; GND/W_SRQ; GND/W_ATN; GND

## Micro-MaTch, 6 pin
designator XS?, comment 7-215079-6
Micro-MaTch Industrial Connector, 6 pin; Manufacturer: TE Connectivity; AltManufacturer1: KLS; Alternative1: L-KLS1-204F-06-R; PartNumber: 7-215079-6; ItemType: Connector; ItemSubType: Micro-MaTch; Mounting: THT
footprint 7-215079-6 (Micro-MaTch Industrial Connector, 6 pin)
pins: 1, 2, 3, 4, 5, 6
text: Pin; Net

## mPCIe WWAN Edge Connector
designator XP?, comment PCB Edge Connector  (no BOM)
Mini PCI Express PCB Edge Connector (mPCIe WWAN); Value: PCB Edge Connector; Mounting: NONE
footprint MINI_PCIE_EDGE_CONNECTOR (Mini PCI Express PCB Edge Connector)
part A pins: 1, 3, 5, 7, 9, 11, 13, 15, 17, 19, 21, 23, 25, 27, 29, 31, 33, 35, 37, 39, 41, 43, 45, 47, 49, 51
part B pins: 2, 4, 6, 8, 10, 12, 14, 16, 18, 20, 22, 24, 26, 28, 30, 32, 34, 36, 38, 40, 42, 44, 46, 48, 50, 52, M1, M2
part A text: Pin; Net; I/O Pin; WAKE#; COEX1; COEX2; CLKREQ#; GND; REFCLK_N; REFCLK_P; MECHANICAL KEY; UIM_C8; UIM_C4; PER0_N; PER0_P; PET0_N; PET0_P; +3.3VAUX; RSVRD45; RSVRD47; RSVRD49; RSVRD51
part B text: Pin; Net; I/O Pin; +3.3V; GND; +1.5V; UIM_PWR; UIM_DATA; UIM_CLK; UIM_RESET; UIM_VPP; MECHANICAL KEY; W_DISABLE#; PERST#; +3.3VAUX; SMB_CLK; SMB_DATA; USB_DM; USB_DP; LED_WWAN#; LED_WLAN#; LED_WPAN#; MECHANICAL

## PicoBlade, 2 pin, Right Angle
designator XP?, comment 53261-0271
1.25mm Pitch, PicoBlade PCB Header; Manufacturer: Molex; AltManufacturer1: Connfly; Alternative1: DS1020-02-02MVT1R; ItemType: Connector; ItemSubType: PicoBlade R/A; PartNumber: 53261-0271; Mounting: SMD
footprint 53261-0271
pins: 1, 2, M1, M2
text: Pin; Net

## PicoBlade, 2 pin, Vertical
designator XP?, comment 53398-0271
1.25mm Pitch, PicoBlade PCB Header; Manufacturer: Molex; AltManufacturer1: Connfly; ItemType: Connector; ItemSubType: PicoBlade V/T; Alternative1: DS1020-03-02MVT1-R; PartNumber: 53398-0271; Mounting: SMD
footprint 53398-0271
pins: 1, 2, M1, M2
text: Pin; Net

## PicoBlade, 3 pin, Right Angle
designator XP?, comment 53261-0371
1.25mm Pitch, PicoBlade PCB Header; Manufacturer: Molex; AltManufacturer1: Connfly; Alternative1: DS1020-02-03MVT1R; ItemType: Connector; ItemSubType: PicoBlade R/A; PartNumber: 53261-0371; Mounting: SMD
footprint 53261-0371
pins: 1, 2, 3, M1, M2
text: Pin; Net

## PicoBlade, 3 pin, Vertical
designator XP?, comment 53398-0371
1.25mm Pitch, PicoBlade PCB Header; Manufacturer: Molex; AltManufacturer1: Connfly; ItemType: Connector; ItemSubType: PicoBlade V/T; Alternative1: DS1020-03-03MVT1-R; PartNumber: 53398-0371; Mounting: SMD
footprint 53398-0371
pins: 1, 2, 3, M1, M2
text: Pin; Net

## PicoBlade, 4 pin, Right Angle
designator XP?, comment 53261-0471
1.25mm Pitch, PicoBlade PCB Header; Manufacturer: Molex; AltManufacturer1: Connfly; Alternative1: DS1020-02-04MVT1R; ItemType: Connector; ItemSubType: PicoBlade R/A; PartNumber: 53261-0471; Mounting: SMD
footprint 53261-0471
pins: 1, 2, 3, 4, M1, M2
text: Pin; Net

## PicoBlade, 4 pin, Vertical
designator XP?, comment 53398-0471
1.25mm Pitch, PicoBlade PCB Header; Manufacturer: Molex; AltManufacturer1: Connfly; ItemType: Connector; ItemSubType: PicoBlade V/T; Alternative1: DS1020-03-04MVT1-R; PartNumber: 53398-0471; Mounting: SMD
footprint 53398-0471
pins: 1, 2, 3, 4, M1, M2
text: Pin; Net

## PicoBlade, 6 pin, Right Angle
designator XP?, comment 53261-0671
1.25mm Pitch, PicoBlade PCB Header; Manufacturer: Molex; AltManufacturer1: Connfly; Alternative1: DS1020-02-06MVT1R; ItemType: Connector; ItemSubType: PicoBlade R/A; PartNumber: 53261-0671; Mounting: SMD
footprint 53261-0671
pins: 1, 2, 3, 4, 5, 6, M1, M2
text: Pin; Net

## PicoBlade, 6 pin, Vertical
designator XP?, comment 53398-0671
1.25mm Pitch, PicoBlade PCB Header; Manufacturer: Molex; AltManufacturer1: Connfly; ItemType: Connector; ItemSubType: PicoBlade V/T; Alternative1: DS1020-03-06MVT1-R; PartNumber: 53398-0671; Mounting: SMD
footprint 53398-0671
pins: 1, 2, 3, 4, 5, 6, M1, M2
text: Pin; Net

## PicoBlade, 10 pin, Right Angle
designator XP?, comment 53261-1071
1.25mm Pitch, PicoBlade PCB Header; Manufacturer: Molex; AltManufacturer1: Connfly; Alternative1: DS1020-02-10MVT1R; ItemType: Connector; ItemSubType: PicoBlade R/A; PartNumber: 53261-1071; Mounting: SMD
footprint 53261-1071
pins: 1, 2, 3, 4, 5, 6, 7, 8, 9, 10, M1, M2
text: Pin; Net

## PicoBlade, 10 pin, Vertical
designator XP?, comment 53398-1071
1.25mm Pitch, PicoBlade PCB Header; Manufacturer: Molex; AltManufacturer1: Connfly; ItemType: Connector; ItemSubType: PicoBlade V/T; Alternative1: DS1020-03-10MVT1-R; PartNumber: 53398-1071; Mounting: SMD
footprint 53398-1071
pins: 1, 2, 3, 4, 5, 6, 7, 8, 9, 10, M1, M2
text: Pin; Net

## SCSM-8 DIP8 Panel
designator XS?, comment DS1001-01-08BT1NSF6X-JKB
DIP8 IC Socket; Manufacturer: Connfly; ItemType: Connector; ItemSubType: DIP Socket; PartNumber: DS1001-01-08BT1NSF6X-JKB; Mounting: THT
footprint SCSM-08 (DIP-8 Panel)
pins: 1, 2, 3, 4, 5, 6, 7, 8
text: Pin; Net

## SCT2004WR-2X2P
designator XP?
3A Through Hole,P=2mm Wire To Board Connector R/A, S10B-PHDSS; Manufacturer: Scondar; PartNumber: SCT2004WR-2X2P; ItemType: Connector; Mounting: THT
footprint SCT2004WR-2X2P
pins: 1, 2, 3, 4
text: Pin; Net

## SCT2004WR-2X5P
designator XP?
3A Through Hole,P=2mm Wire To Board Connector R/A, S10B-PHDSS; Manufacturer: Scondar; PartNumber: SCT2004WR-2X5P; ItemType: Connector; Mounting: THT
footprint SCT2004WR-2X5P
pins: 1, 2, 3, 4, 5, 6, 7, 8, 9, 10
text: Pin; Net

## SCT2004WV-2X2P
designator XP?
3A Through Hole,P=2mm Wire To Board Connector; Manufacturer: Scondar; AltManufacturer1: Joint Tech Elec; Alternative1: A2004WV-2X02P; PartNumber: SCT2004WV-2X2P; ItemType: Connector; Mounting: THT
footprint SCT2004WV-2X2P
pins: 1, 2, 3, 4
text: Pin; Net

## SCT2004WV-2X5P
designator XP?
3A Through Hole,P=2mm Wire To Board Connector; Manufacturer: Scondar; PartNumber: SCT2004WV-2X5P; ItemType: Connector; Mounting: THT
footprint SCT2004WV-2X5P
pins: 1, 2, 3, 4, 5, 6, 7, 8, 9, 10
text: Pin; Net

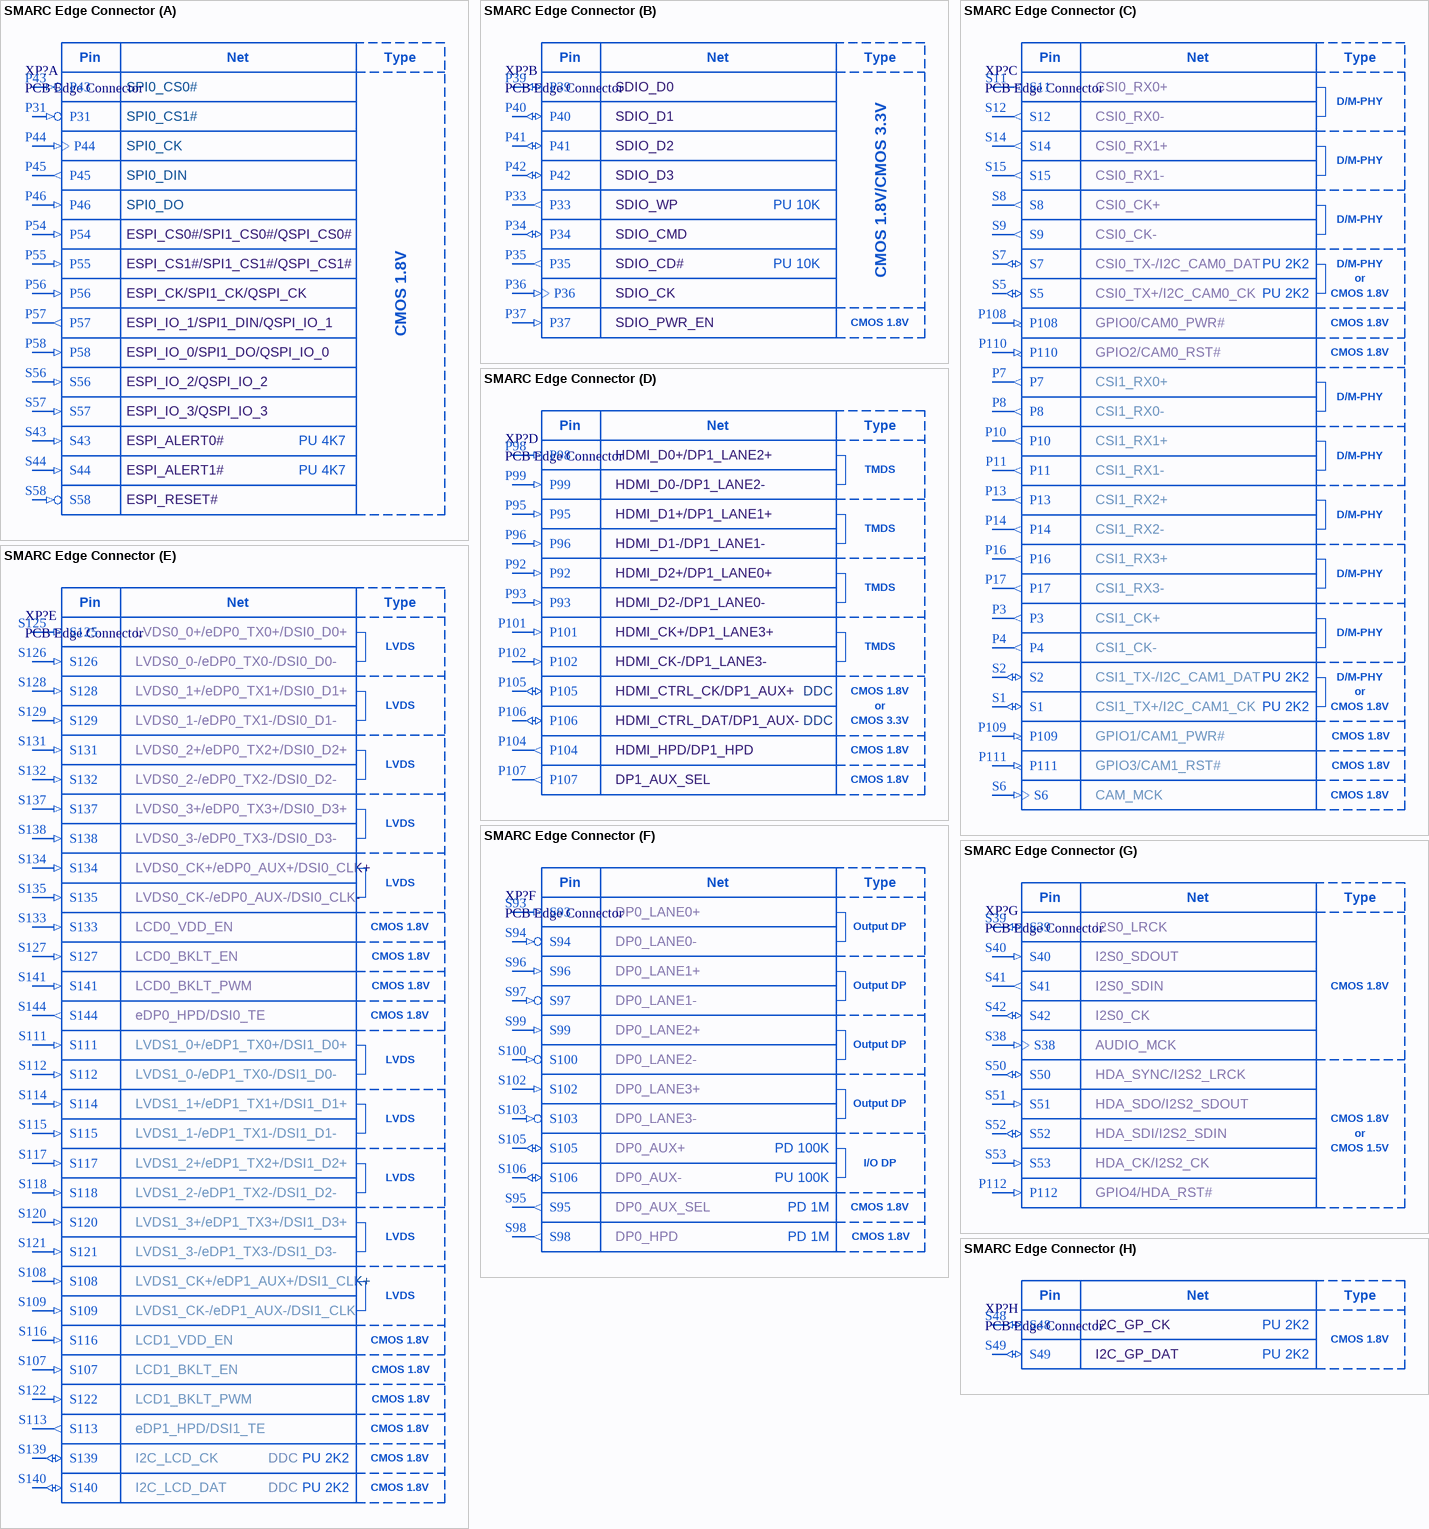
[diagram p8: symbol SMARC Edge Connector]

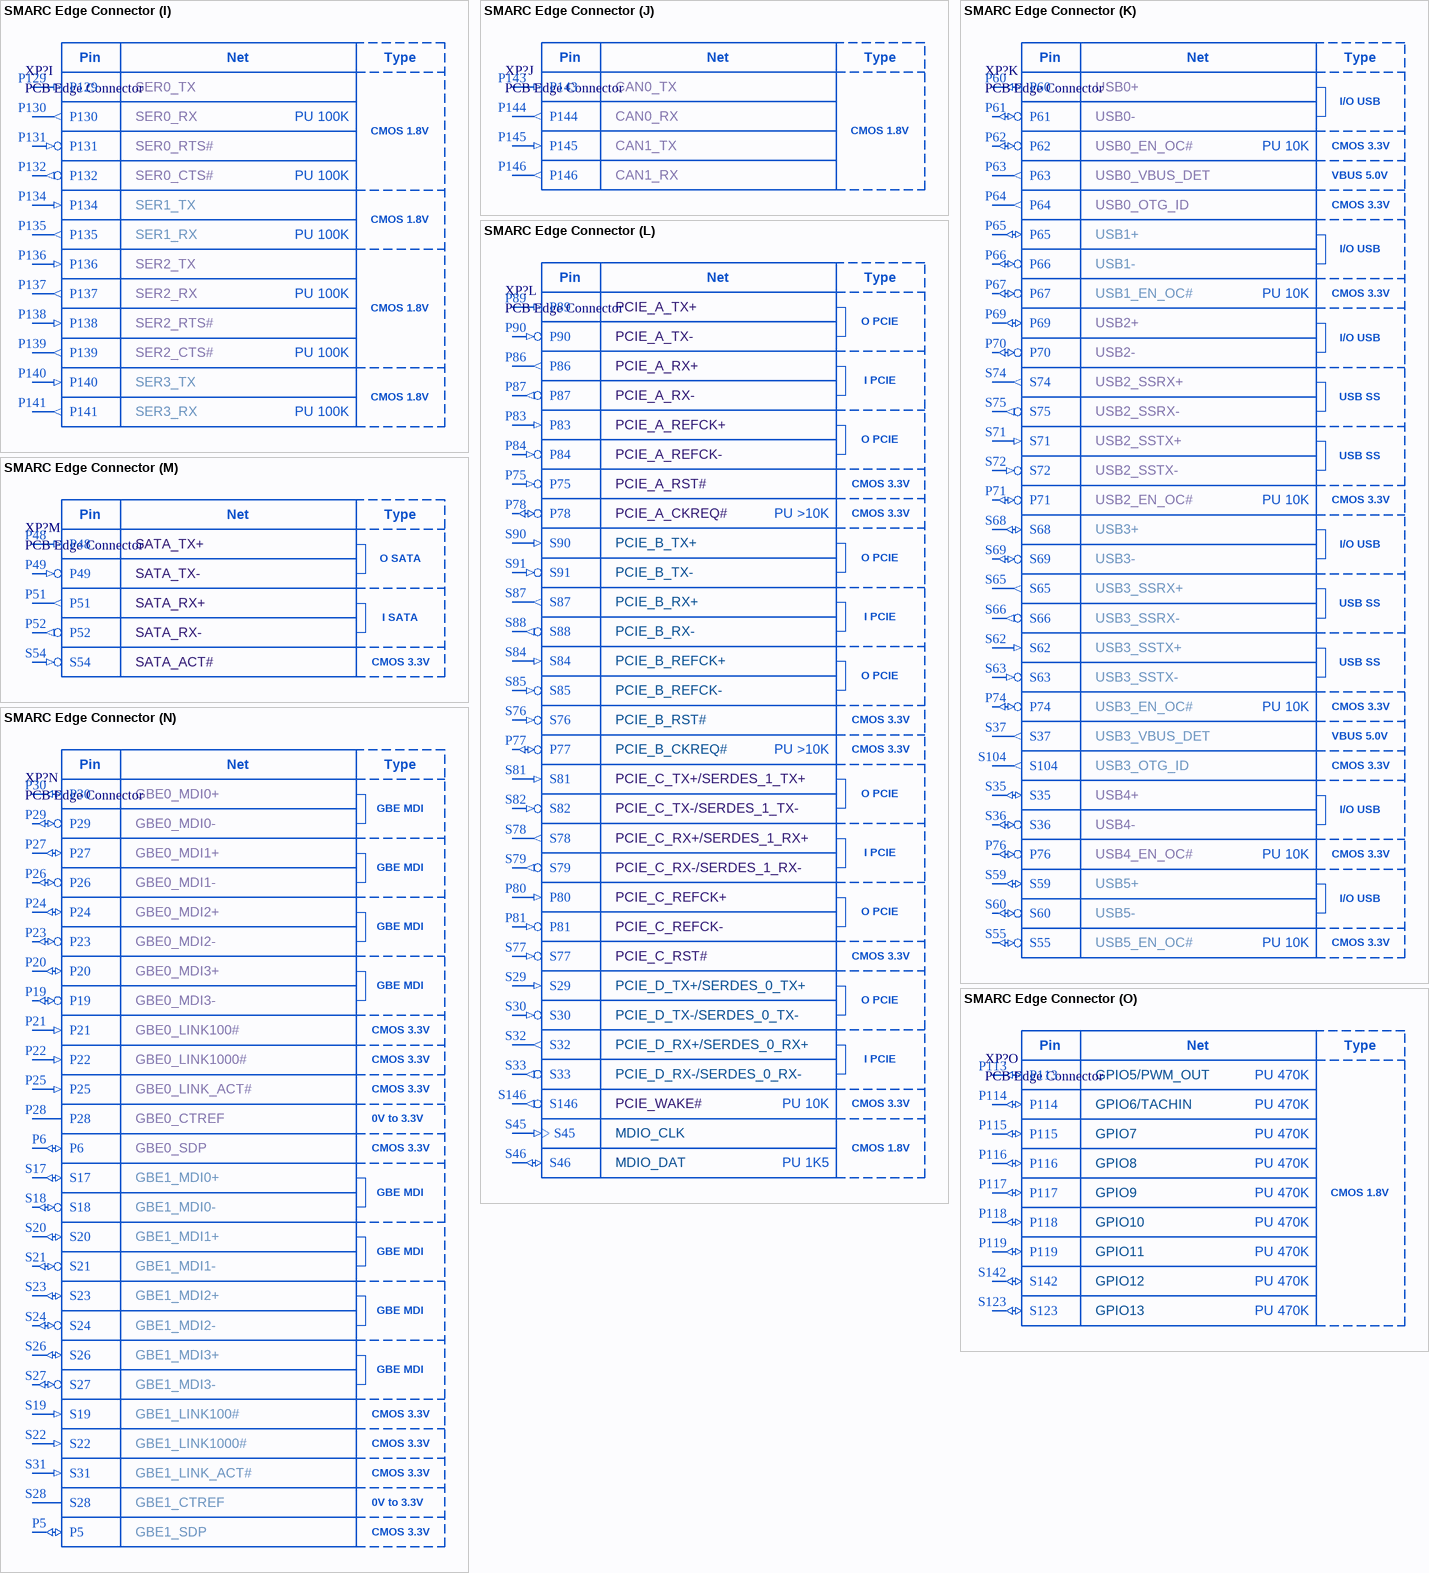
[diagram p9: symbol SMARC Edge Connector]

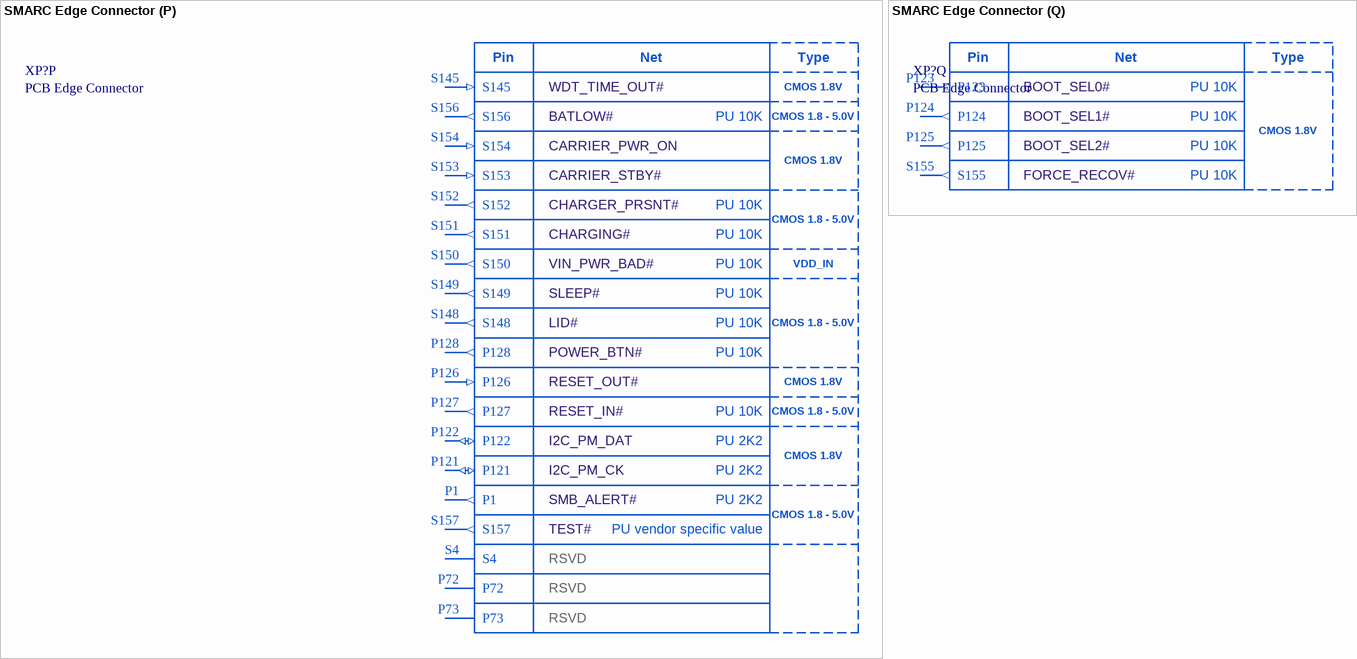
[diagram p10: symbol SMARC Edge Connector]

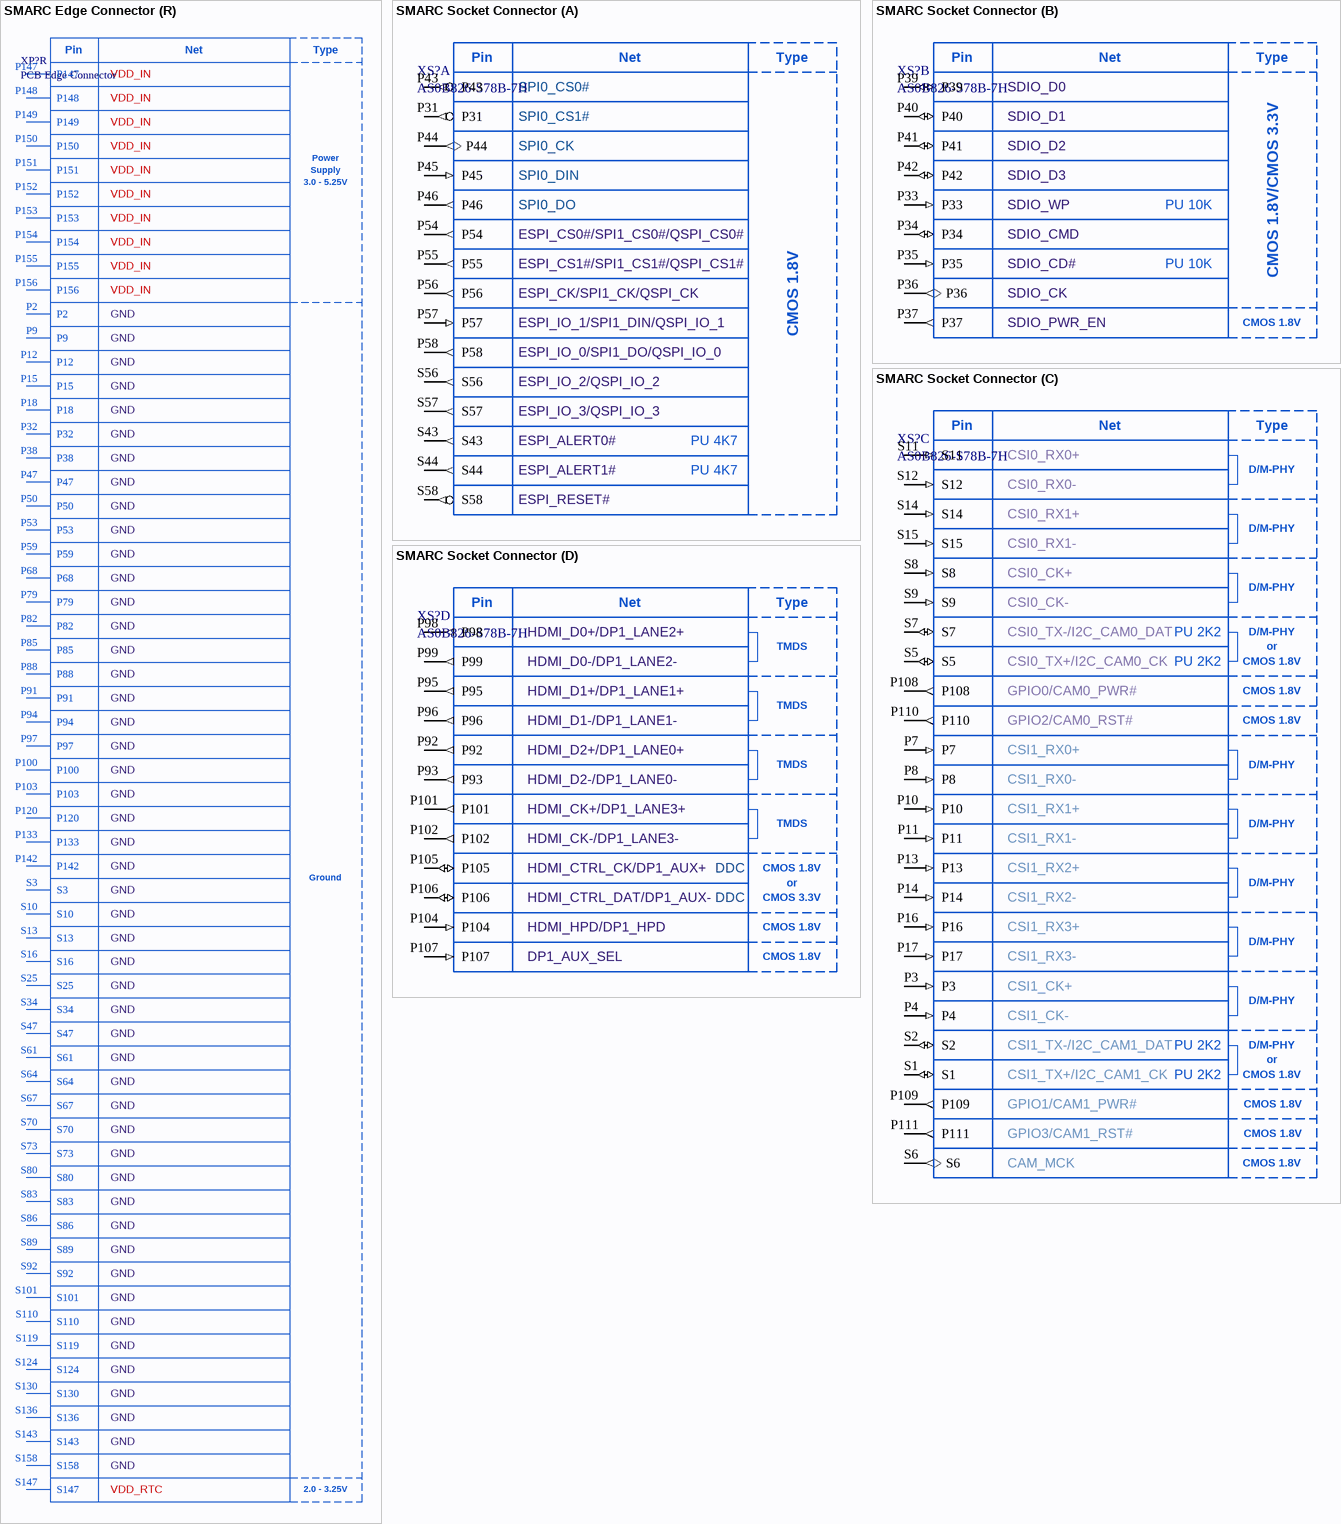
[diagram p11: symbols SMARC Edge Connector to SMARC Socket Connector]

## SMARC Edge Connector
designator XP?, comment PCB Edge Connector  (no BOM)
314-pin MxM PCB Edge Connector, SMARC 2.1.1 pinout; Value: PCB Edge Connector; Mounting: NONE
footprint SMARC_82x50_EDGE_CONNECTOR (MXM3 PCB Edge Connector)
part A pins: P31 (in), P43 (in), P44 (in), P45 (out), P46 (in), P54 (in), P55 (in), P56 (in), P57 (out), P58 (in), S43 (in), S44 (in), S56 (in), S57 (in), S58 (in)
part B pins: P33 (out), P34 (io), P35 (out), P36 (in), P37 (in), P39 (io), P40 (io), P41 (io), P42 (io)
part C pins: P3 (out), P4 (out), P7 (out), P8 (out), P10 (out), P11 (out), P13 (out), P14 (out), P16 (out), P17 (out), P108 (in), P109 (in), P110 (in), P111 (in), S1 (io), S2 (io), S5 (io), S6 (in), S7 (io), S8 (out), S9 (out), S11 (out), S12 (out), S14 (out), S15 (out)
part D pins: P92 (in), P93 (in), P95 (in), P96 (in), P98 (in), P99 (in), P101 (in), P102 (in), P104 (out), P105 (io), P106 (io), P107 (out)
part E pins: S107 (in), S108 (in), S109 (in), S111 (in), S112 (in), S113 (out), S114 (in), S115 (in), S116 (in), S117 (in), S118 (in), S120 (in), S121 (in), S122 (in), S125 (in), S126 (in), S127 (in), S128 (in), S129 (in), S131 (in), S132 (in), S133 (in), S134 (in), S135 (in), S137 (in), S138 (in), S139 (io), S140 (io), S141 (in), S144 (out)
part F pins: S93 (in), S94 (in), S95 (out), S96 (in), S97 (in), S98 (out), S99 (in), S100 (in), S102 (in), S103 (in), S105 (io), S106 (io)
part G pins: P112 (in), S38 (in), S39 (io), S40 (in), S41 (out), S42 (io), S50 (io), S51 (in), S52 (io), S53 (in)
part H pins: S48 (io), S49 (io)
part I pins: P129 (in), P130 (out), P131 (in), P132 (out), P134 (in), P135 (out), P136 (in), P137 (out), P138 (in), P139 (out), P140 (in), P141 (out)
part J pins: P143 (in), P144 (out), P145 (in), P146 (out)
part K pins: P60 (io), P61 (io), P62 (io), P63 (out), P64 (out), P65 (io), P66 (io), P67 (io), P69 (io), P70 (io), P71 (io), P74 (io), P76 (io), S35 (io), S36 (io), S37 (out), S55 (io), S59 (io), S60 (io), S62 (in), S63 (in), S65 (out), S66 (out), S68 (io), S69 (io), S71 (in), S72 (in), S74 (out), S75 (out), S104 (out)
part L pins: P75 (in), P77 (io), P78 (io), P80 (in), P81 (in), P83 (in), P84 (in), P86 (out), P87 (out), P89 (in), P90 (in), S29 (in), S30 (in), S32 (out), S33 (out), S45 (in), S46 (io), S76 (in), S77 (in), S78 (out), S79 (out), S81 (in), S82 (in), S84 (in), S85 (in), S87 (out), S88 (out), S90 (in), S91 (in), S146 (out)
part M pins: P48 (in), P49 (in), P51 (out), P52 (out), S54 (in)
part N pins: P5 (io), P6 (io), P19 (io), P20 (io), P21 (in), P22 (in), P23 (io), P24 (io), P25 (in), P26 (io), P27 (io), P28, P29 (io), P30 (io), S17 (io), S18 (io), S19 (in), S20 (io), S21 (io), S22 (in), S23 (io), S24 (io), S26 (io), S27 (io), S28, S31 (in)
part O pins: P113 (io), P114 (io), P115 (io), P116 (io), P117 (io), P118 (io), P119 (io), S123 (io), S142 (io)
part P pins: P1 (out), P72 (hiz), P73 (hiz), P121 (io), P122 (io), P126 (in), P127 (out), P128 (out), S4 (hiz), S145 (in), S148 (out), S149 (out), S150 (out), S151 (out), S152 (out), S153 (in), S154 (in), S156 (out), S157 (out)
part Q pins: P123 (out), P124 (out), P125 (out), S155 (out)
part R pins: P2 (power), P9 (power), P12 (power), P15 (power), P18 (power), P32 (power), P38 (power), P47 (power), P50 (power), P53 (power), P59 (power), P68 (power), P79 (power), P82 (power), P85 (power), P88 (power), P91 (power), P94 (power), P97 (power), P100 (power), P103 (power), P120 (power), P133 (power), P142 (power), P147 (power), P148 (power), P149 (power), P150 (power), P151 (power), P152 (power), P153 (power), P154 (power), P155 (power), P156 (power), S3 (power), S10 (power), S13 (power), S16 (power), S25 (power), S34 (power), S47 (power), S61 (power), S64 (power), S67 (power), S70 (power), S73 (power), S80 (power), S83 (power), S86 (power), S89 (power), S92 (power), S101 (power), S110 (power), S119 (power), S124 (power), S130 (power), S136 (power), S143 (power), S147 (power), S158 (power)
part A text: Pin; Net; Type; SPI0_CS0#; SPI0_CS1#; SPI0_CK; SPI0_DIN; SPI0_DO; ESPI_CS0#/SPI1_CS0#/QSPI_CS0#; ESPI_CS1#/SPI1_CS1#/QSPI_CS1#; ESPI_CK/SPI1_CK/QSPI_CK; CMOS 1.8V; ESPI_IO_1/SPI1_DIN/QSPI_IO_1; ESPI_IO_0/SPI1_DO/QSPI_IO_0; ESPI_IO_2/QSPI_IO_2; ESPI_IO_3/QSPI_IO_3; ESPI_ALERT0#; PU 4K7; ESPI_ALERT1#; ESPI_RESET#
part B text: Pin; Net; Type; SDIO_D0; SDIO_D1; SDIO_D2; SDIO_D3; SDIO_WP; PU 10K; SDIO_CMD; SDIO_CD#; CMOS 1.8V/CMOS 3.3V; SDIO_CK; SDIO_PWR_EN; CMOS 1.8V
part C text: Pin; Net; Type; CSI0_RX0+; D/M-PHY; CSI0_RX0-; CSI0_RX1+; CSI0_RX1-; CSI0_CK+; CSI0_CK-; CSI0_TX-/I2C_CAM0_DAT; PU 2K2; or; CSI0_TX+/I2C_CAM0_CK; CMOS 1.8V; GPIO0/CAM0_PWR#; GPIO2/CAM0_RST#; CSI1_RX0+; CSI1_RX0-; CSI1_RX1+; CSI1_RX1-; CSI1_RX2+; CSI1_RX2-; CSI1_RX3+; CSI1_RX3-; CSI1_CK+; CSI1_CK-; CSI1_TX-/I2C_CAM1_DAT; CSI1_TX+/I2C_CAM1_CK; GPIO1/CAM1_PWR#; GPIO3/CAM1_RST#; CAM_MCK
part D text: Pin; Net; Type; HDMI_D0+/DP1_LANE2+; TMDS; HDMI_D0-/DP1_LANE2-; HDMI_D1+/DP1_LANE1+; HDMI_D1-/DP1_LANE1-; HDMI_D2+/DP1_LANE0+; HDMI_D2-/DP1_LANE0-; HDMI_CK+/DP1_LANE3+; HDMI_CK-/DP1_LANE3-; HDMI_CTRL_CK/DP1_AUX+; DDC; CMOS 1.8V; or; HDMI_CTRL_DAT/DP1_AUX-; CMOS 3.3V; HDMI_HPD/DP1_HPD; DP1_AUX_SEL
part E text: Pin; Net; Type; LVDS0_0+/eDP0_TX0+/DSI0_D0+; LVDS; LVDS0_0-/eDP0_TX0-/DSI0_D0-; LVDS0_1+/eDP0_TX1+/DSI0_D1+; LVDS0_1-/eDP0_TX1-/DSI0_D1-; LVDS0_2+/eDP0_TX2+/DSI0_D2+; LVDS0_2-/eDP0_TX2-/DSI0_D2-; LVDS0_3+/eDP0_TX3+/DSI0_D3+; LVDS0_3-/eDP0_TX3-/DSI0_D3-; LVDS0_CK+/eDP0_AUX+/DSI0_CLK+; LVDS0_CK-/eDP0_AUX-/DSI0_CLK-; LCD0_VDD_EN; CMOS 1.8V; LCD0_BKLT_EN; LCD0_BKLT_PWM; eDP0_HPD/DSI0_TE; LVDS1_0+/eDP1_TX0+/DSI1_D0+; LVDS1_0-/eDP1_TX0-/DSI1_D0-; LVDS1_1+/eDP1_TX1+/DSI1_D1+; LVDS1_1-/eDP1_TX1-/DSI1_D1-; LVDS1_2+/eDP1_TX2+/DSI1_D2+; LVDS1_2-/eDP1_TX2-/DSI1_D2-; LVDS1_3+/eDP1_TX3+/DSI1_D3+; LVDS1_3-/eDP1_TX3-/DSI1_D3-; LVDS1_CK+/eDP1_AUX+/DSI1_CLK+; LVDS1_CK-/eDP1_AUX-/DSI1_CLK; LCD1_VDD_EN; LCD1_BKLT_EN; LCD1_BKLT_PWM; eDP1_HPD/DSI1_TE; I2C_LCD_CK; DDC; PU 2K2; I2C_LCD_DAT
part F text: Pin; Net; Type; DP0_LANE0+; Output DP; DP0_LANE0-; DP0_LANE1+; DP0_LANE1-; DP0_LANE2+; DP0_LANE2-; DP0_LANE3+; DP0_LANE3-; DP0_AUX+; PD 100K; I/O DP; DP0_AUX-; PU 100K; DP0_AUX_SEL; PD 1M; CMOS 1.8V; DP0_HPD
part G text: Pin; Net; Type; I2S0_LRCK; I2S0_SDOUT; I2S0_SDIN; CMOS 1.8V; I2S0_CK; AUDIO_MCK; HDA_SYNC/I2S2_LRCK; HDA_SDO/I2S2_SDOUT; HDA_SDI/I2S2_SDIN; or; CMOS 1.5V; HDA_CK/I2S2_CK; GPIO4/HDA_RST#
part H text: Pin; Net; Type; I2C_GP_CK; PU 2K2; CMOS 1.8V; I2C_GP_DAT
part I text: Pin; Net; Type; SER0_TX; SER0_RX; PU 100K; CMOS 1.8V; SER0_RTS#; SER0_CTS#; SER1_TX; SER1_RX; SER2_TX; SER2_RX; SER2_RTS#; SER2_CTS#; SER3_TX; SER3_RX
part J text: Pin; Net; Type; CAN0_TX; CAN0_RX; CMOS 1.8V; CAN1_TX; CAN1_RX
part K text: Pin; Net; Type; USB0+; I/O USB; USB0-; USB0_EN_OC#; PU 10K; CMOS 3.3V; USB0_VBUS_DET; VBUS 5.0V; USB0_OTG_ID; USB1+; USB1-; USB1_EN_OC#; USB2+; USB2-; USB2_SSRX+; USB SS; USB2_SSRX-; USB2_SSTX+; USB2_SSTX-; USB2_EN_OC#; USB3+; USB3-; USB3_SSRX+; USB3_SSRX-; USB3_SSTX+; USB3_SSTX-; USB3_EN_OC#; USB3_VBUS_DET; USB3_OTG_ID; USB4+; USB4-; USB4_EN_OC#; USB5+; USB5-; USB5_EN_OC#
part L text: Pin; Net; Type; PCIE_A_TX+; O PCIE; PCIE_A_TX-; PCIE_A_RX+; I PCIE; PCIE_A_RX-; PCIE_A_REFCK+; PCIE_A_REFCK-; PCIE_A_RST#; CMOS 3.3V; PCIE_A_CKREQ#; PU >10K; PCIE_B_TX+; PCIE_B_TX-; PCIE_B_RX+; PCIE_B_RX-; PCIE_B_REFCK+; PCIE_B_REFCK-; PCIE_B_RST#; PCIE_B_CKREQ#; PCIE_C_TX+/SERDES_1_TX+; PCIE_C_TX-/SERDES_1_TX-; PCIE_C_RX+/SERDES_1_RX+; PCIE_C_RX-/SERDES_1_RX-; PCIE_C_REFCK+; PCIE_C_REFCK-; PCIE_C_RST#; PCIE_D_TX+/SERDES_0_TX+; PCIE_D_TX-/SERDES_0_TX-; PCIE_D_RX+/SERDES_0_RX+; PCIE_D_RX-/SERDES_0_RX-; PCIE_WAKE#; PU 10K; MDIO_CLK; CMOS 1.8V; MDIO_DAT; PU 1K5
part M text: Pin; Net; Type; SATA_TX+; O SATA; SATA_TX-; SATA_RX+; I SATA; SATA_RX-; SATA_ACT#; CMOS 3.3V
part N text: Pin; Net; Type; GBE0_MDI0+; GBE MDI; GBE0_MDI0-; GBE0_MDI1+; GBE0_MDI1-; GBE0_MDI2+; GBE0_MDI2-; GBE0_MDI3+; GBE0_MDI3-; GBE0_LINK100#; CMOS 3.3V; GBE0_LINK1000#; GBE0_LINK_ACT#; GBE0_CTREF; 0V to 3.3V; GBE0_SDP; GBE1_MDI0+; GBE1_MDI0-; GBE1_MDI1+; GBE1_MDI1-; GBE1_MDI2+; GBE1_MDI2-; GBE1_MDI3+; GBE1_MDI3-; GBE1_LINK100#; GBE1_LINK1000#; GBE1_LINK_ACT#; GBE1_CTREF; GBE1_SDP
part O text: Pin; Net; Type; GPIO5/PWM_OUT; PU 470K; GPIO6/TACHIN; GPIO7; GPIO8; GPIO9; CMOS 1.8V; GPIO10; GPIO11; GPIO12; GPIO13
part P text: Pin; Net; Type; WDT_TIME_OUT#; CMOS 1.8V; BATLOW#; PU 10K; CMOS 1.8 - 5.0V; CARRIER_PWR_ON; CARRIER_STBY#; CHARGER_PRSNT#; CHARGING#; VIN_PWR_BAD#; VDD_IN; SLEEP#; LID#; POWER_BTN#; RESET_OUT#; RESET_IN#; I2C_PM_DAT; PU 2K2; I2C_PM_CK; SMB_ALERT#; TEST#; PU vendor specific value; RSVD
part Q text: Pin; Net; Type; BOOT_SEL0#; PU 10K; BOOT_SEL1#; CMOS 1.8V; BOOT_SEL2#; FORCE_RECOV#
part R text: Pin; Net; Type; VDD_IN; Power; Supply; 3.0 - 5.25V; GND; Ground; VDD_RTC; 2.0 - 3.25V

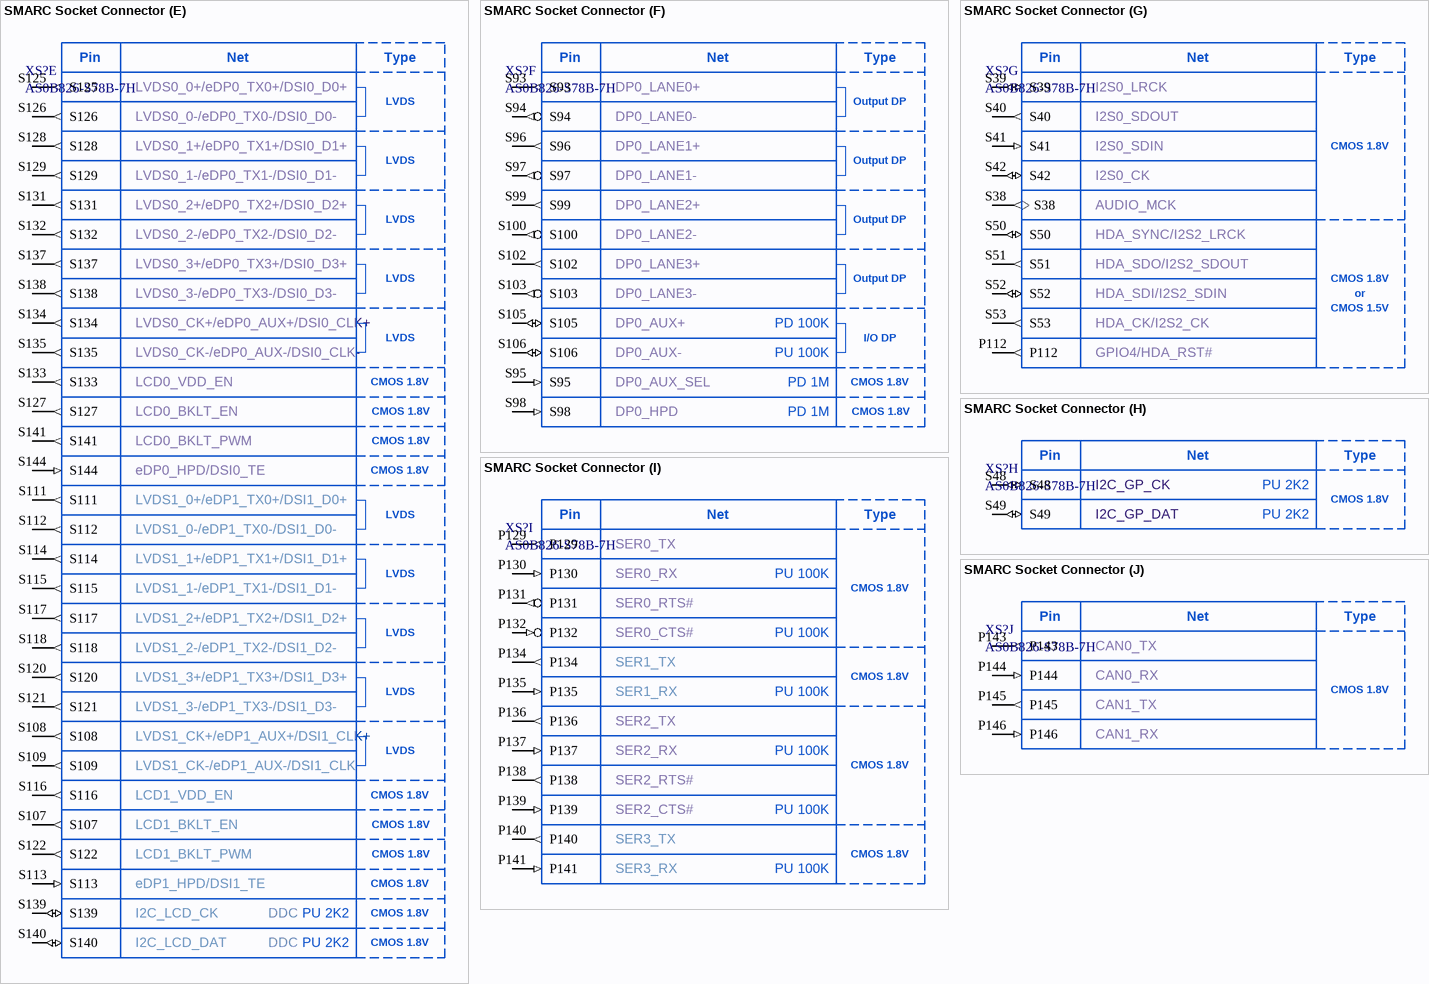
[diagram p12: symbol SMARC Socket Connector]

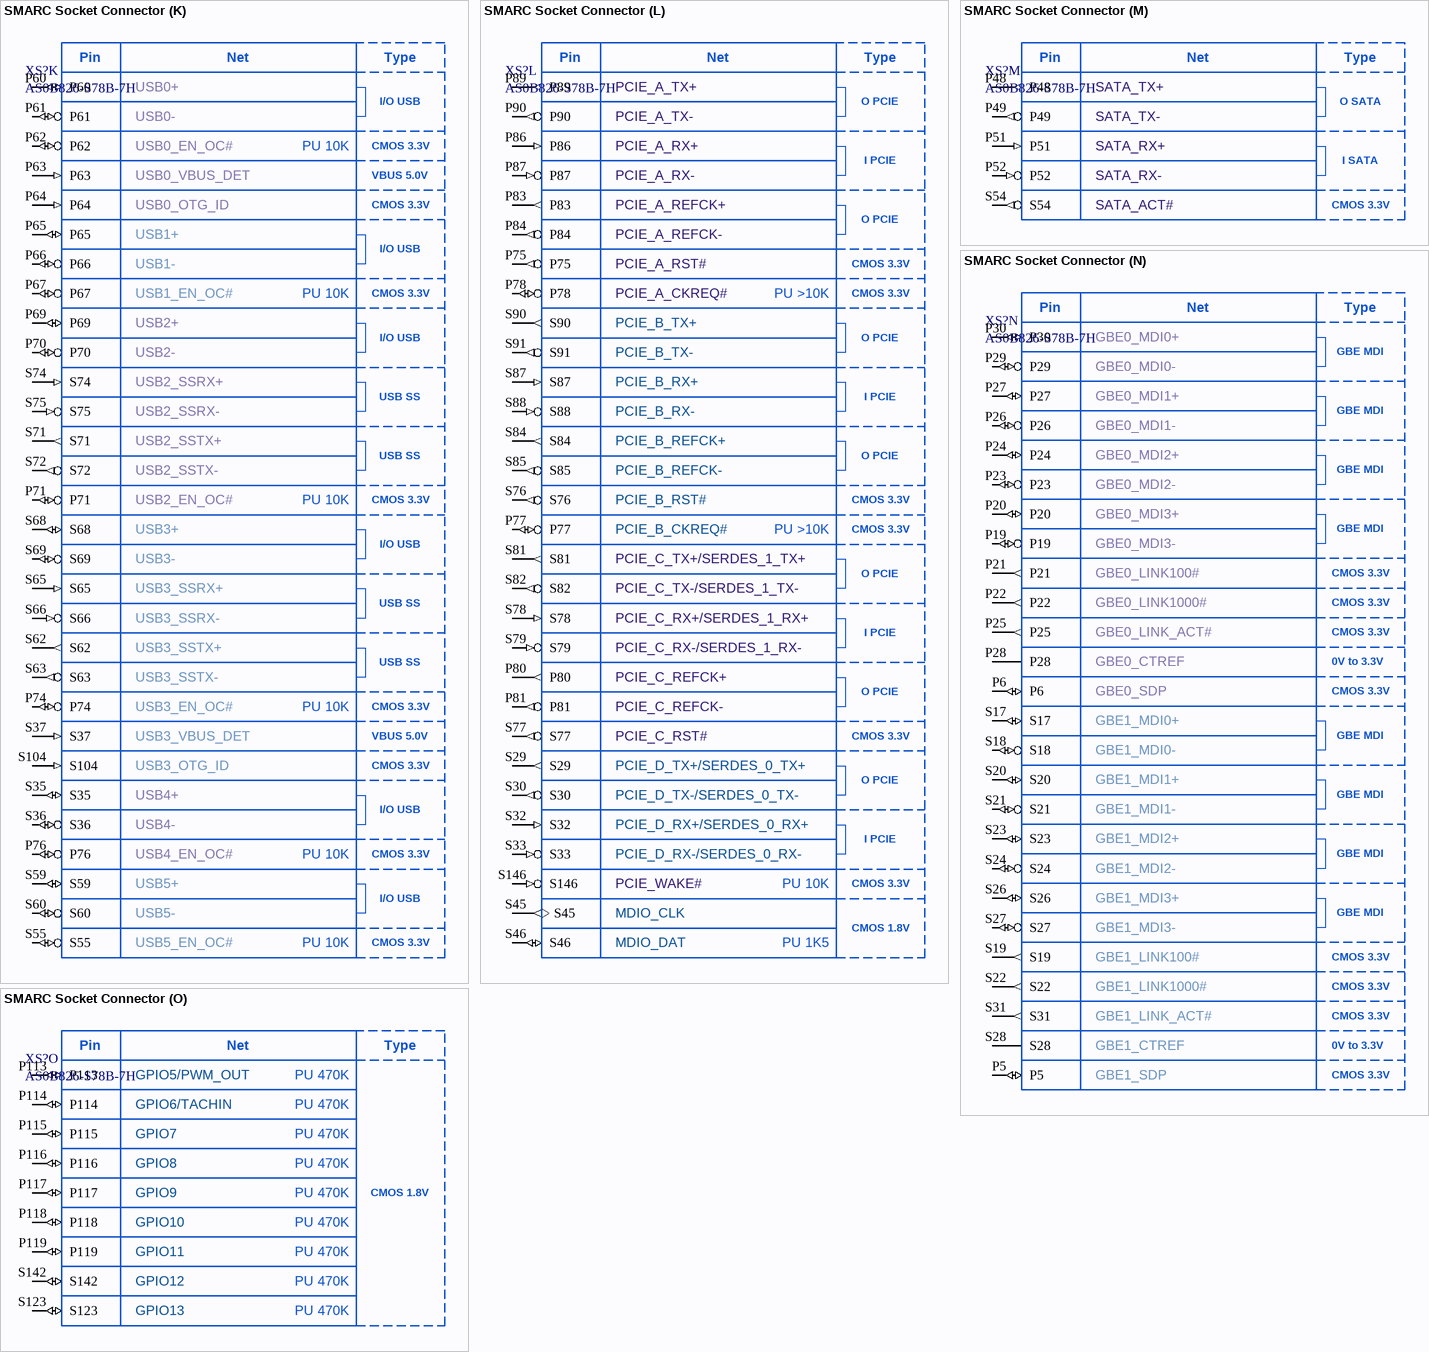
[diagram p13: symbol SMARC Socket Connector]

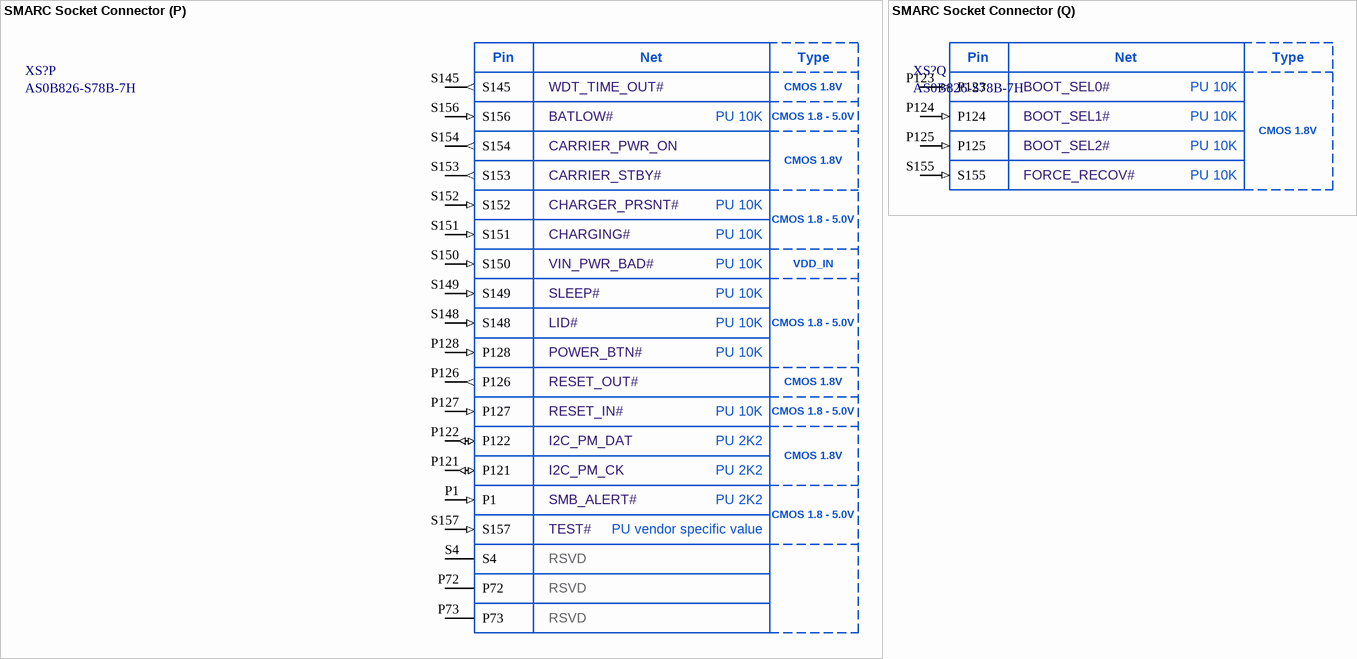
[diagram p14: symbol SMARC Socket Connector]

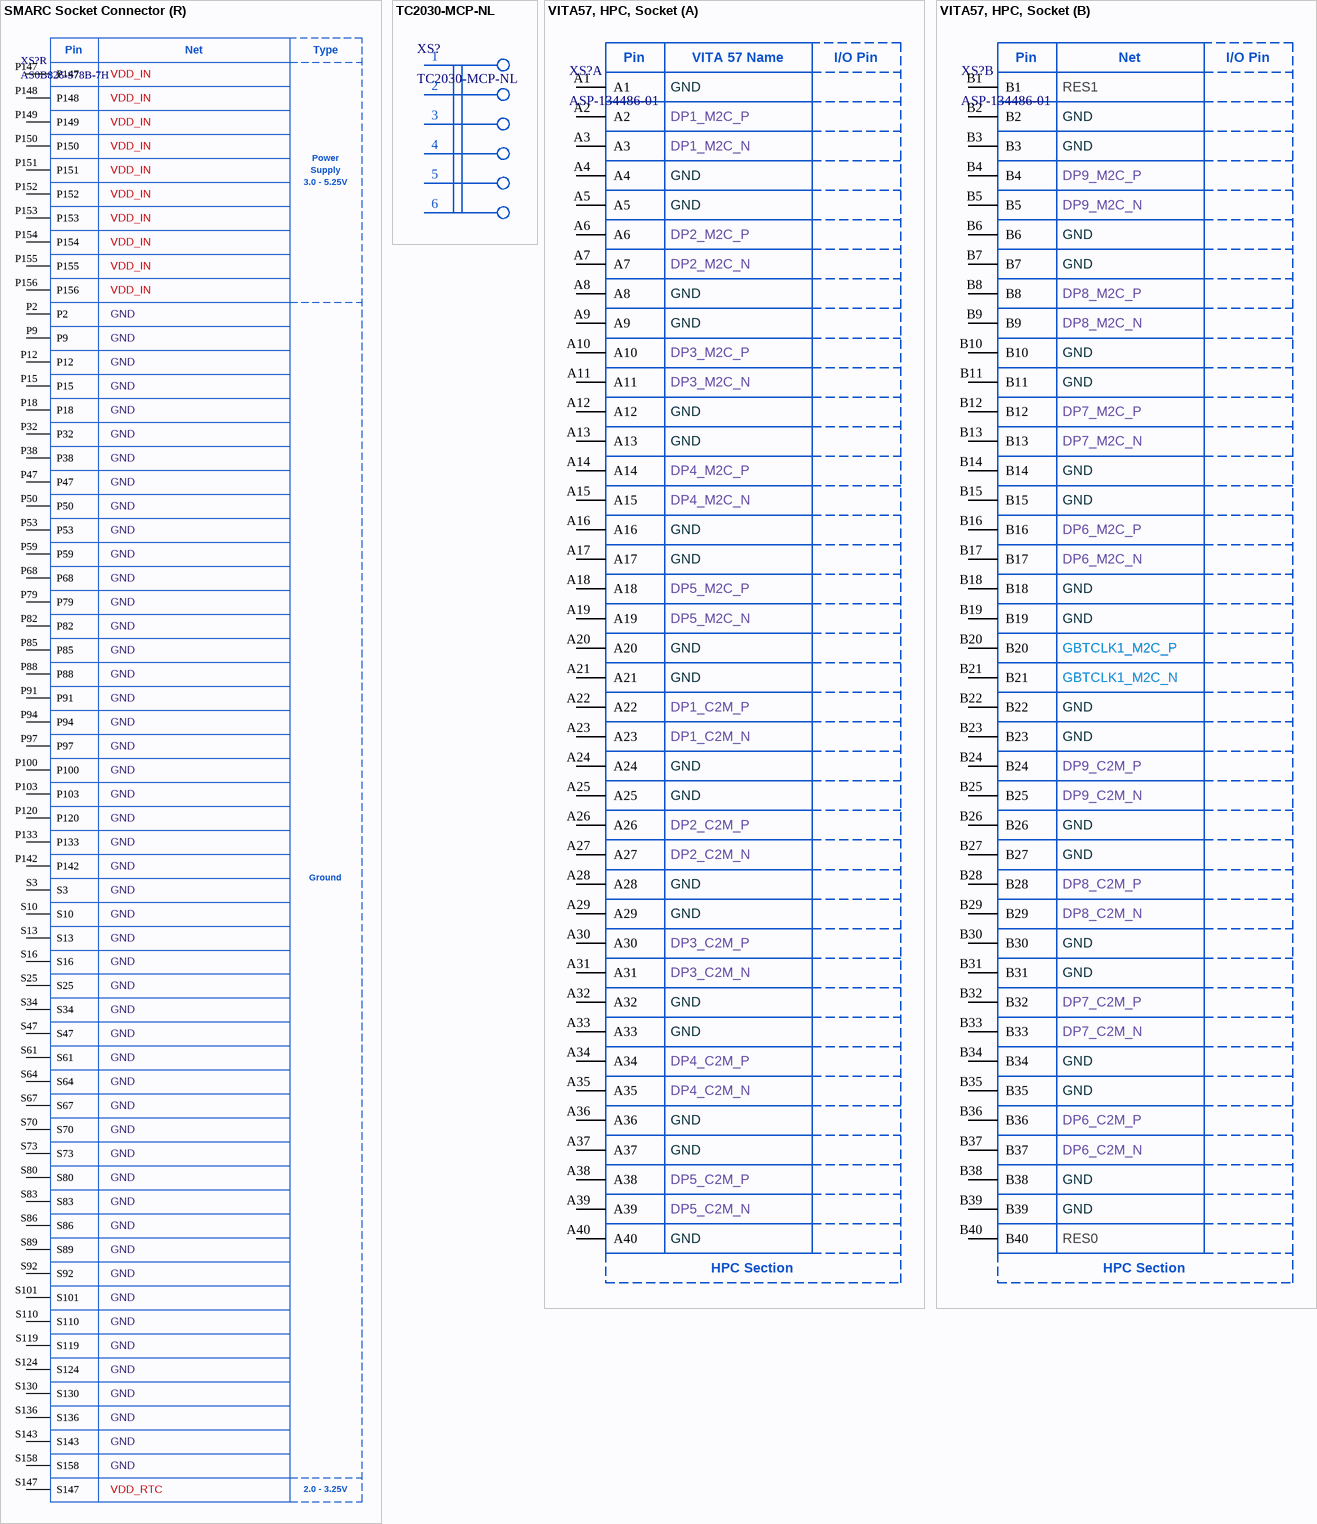
[diagram p15: symbols SMARC Socket Connector to VITA57, HPC, Socket]

## SMARC Socket Connector
designator XS?, comment AS0B826-S78B-7H
314-pin MxM Card Edge Connector, SMARC 2.1.1 pinout; Manufacturer: Foxconn; Alternative1: AS0B821-S78B-7H; ItemSubType: MXM3; PartNumber: AS0B826-S78B-7H; AltManufacturer1: Foxconn; ItemType: Connector; Mounting: SMD
footprint AS0B82X-S78B-XH (MXM3.0 Compatible Connector (SMARC 2.1))
footprint AS0B82X-S78B-XH_with_holes (MXM3.0 Compatible Connector (SMARC 2.1))
part A pins: P31 (out), P43 (out), P44 (out), P45 (in), P46 (out), P54 (out), P55 (out), P56 (out), P57 (in), P58 (out), S43 (out), S44 (out), S56 (out), S57 (out), S58 (out)
part B pins: P33 (in), P34 (io), P35 (in), P36 (out), P37 (out), P39 (io), P40 (io), P41 (io), P42 (io)
part C pins: P3 (in), P4 (in), P7 (in), P8 (in), P10 (in), P11 (in), P13 (in), P14 (in), P16 (in), P17 (in), P108 (out), P109 (out), P110 (out), P111 (out), S1 (io), S2 (io), S5 (io), S6 (out), S7 (io), S8 (in), S9 (in), S11 (in), S12 (in), S14 (in), S15 (in)
part D pins: P92 (out), P93 (out), P95 (out), P96 (out), P98 (out), P99 (out), P101 (out), P102 (out), P104 (in), P105 (io), P106 (io), P107 (in)
part E pins: S107 (out), S108 (out), S109 (out), S111 (out), S112 (out), S113 (in), S114 (out), S115 (out), S116 (out), S117 (out), S118 (out), S120 (out), S121 (out), S122 (out), S125 (out), S126 (out), S127 (out), S128 (out), S129 (out), S131 (out), S132 (out), S133 (out), S134 (out), S135 (out), S137 (out), S138 (out), S139 (io), S140 (io), S141 (out), S144 (in)
part F pins: S93 (out), S94 (out), S95 (in), S96 (out), S97 (out), S98 (in), S99 (out), S100 (out), S102 (out), S103 (out), S105 (io), S106 (io)
part G pins: P112 (out), S38 (out), S39 (io), S40 (out), S41 (in), S42 (io), S50 (io), S51 (out), S52 (io), S53 (out)
part H pins: S48 (io), S49 (io)
part I pins: P129 (out), P130 (in), P131 (out), P132 (in), P134 (out), P135 (in), P136 (out), P137 (in), P138 (out), P139 (in), P140 (out), P141 (in)
part J pins: P143 (out), P144 (in), P145 (out), P146 (in)
part K pins: P60 (io), P61 (io), P62 (io), P63 (in), P64 (in), P65 (io), P66 (io), P67 (io), P69 (io), P70 (io), P71 (io), P74 (io), P76 (io), S35 (io), S36 (io), S37 (in), S55 (io), S59 (io), S60 (io), S62 (out), S63 (out), S65 (in), S66 (in), S68 (io), S69 (io), S71 (out), S72 (out), S74 (in), S75 (in), S104 (in)
part L pins: P75 (out), P77 (io), P78 (io), P80 (out), P81 (out), P83 (out), P84 (out), P86 (in), P87 (in), P89 (out), P90 (out), S29 (out), S30 (out), S32 (in), S33 (in), S45 (out), S46 (io), S76 (out), S77 (out), S78 (in), S79 (in), S81 (out), S82 (out), S84 (out), S85 (out), S87 (in), S88 (in), S90 (out), S91 (out), S146 (in)
part M pins: P48 (out), P49 (out), P51 (in), P52 (in), S54 (out)
part N pins: P5 (io), P6 (io), P19 (io), P20 (io), P21 (out), P22 (out), P23 (io), P24 (io), P25 (out), P26 (io), P27 (io), P28, P29 (io), P30 (io), S17 (io), S18 (io), S19 (out), S20 (io), S21 (io), S22 (out), S23 (io), S24 (io), S26 (io), S27 (io), S28, S31 (out)
part O pins: P113 (io), P114 (io), P115 (io), P116 (io), P117 (io), P118 (io), P119 (io), S123 (io), S142 (io)
part P pins: P1 (in), P72 (hiz), P73 (hiz), P121 (io), P122 (io), P126 (out), P127 (in), P128 (in), S4 (hiz), S145 (out), S148 (in), S149 (in), S150 (in), S151 (in), S152 (in), S153 (out), S154 (out), S156 (in), S157 (in)
part Q pins: P123 (in), P124 (in), P125 (in), S155 (in)
part R pins: P2 (power), P9 (power), P12 (power), P15 (power), P18 (power), P32 (power), P38 (power), P47 (power), P50 (power), P53 (power), P59 (power), P68 (power), P79 (power), P82 (power), P85 (power), P88 (power), P91 (power), P94 (power), P97 (power), P100 (power), P103 (power), P120 (power), P133 (power), P142 (power), P147 (power), P148 (power), P149 (power), P150 (power), P151 (power), P152 (power), P153 (power), P154 (power), P155 (power), P156 (power), S3 (power), S10 (power), S13 (power), S16 (power), S25 (power), S34 (power), S47 (power), S61 (power), S64 (power), S67 (power), S70 (power), S73 (power), S80 (power), S83 (power), S86 (power), S89 (power), S92 (power), S101 (power), S110 (power), S119 (power), S124 (power), S130 (power), S136 (power), S143 (power), S147 (power), S158 (power)
part A text: Pin; Net; Type; SPI0_CS0#; SPI0_CS1#; SPI0_CK; SPI0_DIN; SPI0_DO; ESPI_CS0#/SPI1_CS0#/QSPI_CS0#; ESPI_CS1#/SPI1_CS1#/QSPI_CS1#; ESPI_CK/SPI1_CK/QSPI_CK; CMOS 1.8V; ESPI_IO_1/SPI1_DIN/QSPI_IO_1; ESPI_IO_0/SPI1_DO/QSPI_IO_0; ESPI_IO_2/QSPI_IO_2; ESPI_IO_3/QSPI_IO_3; ESPI_ALERT0#; PU 4K7; ESPI_ALERT1#; ESPI_RESET#
part B text: Pin; Net; Type; SDIO_D0; SDIO_D1; SDIO_D2; SDIO_D3; SDIO_WP; PU 10K; SDIO_CMD; SDIO_CD#; CMOS 1.8V/CMOS 3.3V; SDIO_CK; SDIO_PWR_EN; CMOS 1.8V
part C text: Pin; Net; Type; CSI0_RX0+; D/M-PHY; CSI0_RX0-; CSI0_RX1+; CSI0_RX1-; CSI0_CK+; CSI0_CK-; CSI0_TX-/I2C_CAM0_DAT; PU 2K2; or; CSI0_TX+/I2C_CAM0_CK; CMOS 1.8V; GPIO0/CAM0_PWR#; GPIO2/CAM0_RST#; CSI1_RX0+; CSI1_RX0-; CSI1_RX1+; CSI1_RX1-; CSI1_RX2+; CSI1_RX2-; CSI1_RX3+; CSI1_RX3-; CSI1_CK+; CSI1_CK-; CSI1_TX-/I2C_CAM1_DAT; CSI1_TX+/I2C_CAM1_CK; GPIO1/CAM1_PWR#; GPIO3/CAM1_RST#; CAM_MCK
part D text: Pin; Net; Type; HDMI_D0+/DP1_LANE2+; TMDS; HDMI_D0-/DP1_LANE2-; HDMI_D1+/DP1_LANE1+; HDMI_D1-/DP1_LANE1-; HDMI_D2+/DP1_LANE0+; HDMI_D2-/DP1_LANE0-; HDMI_CK+/DP1_LANE3+; HDMI_CK-/DP1_LANE3-; HDMI_CTRL_CK/DP1_AUX+; DDC; CMOS 1.8V; or; HDMI_CTRL_DAT/DP1_AUX-; CMOS 3.3V; HDMI_HPD/DP1_HPD; DP1_AUX_SEL
part E text: Pin; Net; Type; LVDS0_0+/eDP0_TX0+/DSI0_D0+; LVDS; LVDS0_0-/eDP0_TX0-/DSI0_D0-; LVDS0_1+/eDP0_TX1+/DSI0_D1+; LVDS0_1-/eDP0_TX1-/DSI0_D1-; LVDS0_2+/eDP0_TX2+/DSI0_D2+; LVDS0_2-/eDP0_TX2-/DSI0_D2-; LVDS0_3+/eDP0_TX3+/DSI0_D3+; LVDS0_3-/eDP0_TX3-/DSI0_D3-; LVDS0_CK+/eDP0_AUX+/DSI0_CLK+; LVDS0_CK-/eDP0_AUX-/DSI0_CLK-; LCD0_VDD_EN; CMOS 1.8V; LCD0_BKLT_EN; LCD0_BKLT_PWM; eDP0_HPD/DSI0_TE; LVDS1_0+/eDP1_TX0+/DSI1_D0+; LVDS1_0-/eDP1_TX0-/DSI1_D0-; LVDS1_1+/eDP1_TX1+/DSI1_D1+; LVDS1_1-/eDP1_TX1-/DSI1_D1-; LVDS1_2+/eDP1_TX2+/DSI1_D2+; LVDS1_2-/eDP1_TX2-/DSI1_D2-; LVDS1_3+/eDP1_TX3+/DSI1_D3+; LVDS1_3-/eDP1_TX3-/DSI1_D3-; LVDS1_CK+/eDP1_AUX+/DSI1_CLK+; LVDS1_CK-/eDP1_AUX-/DSI1_CLK; LCD1_VDD_EN; LCD1_BKLT_EN; LCD1_BKLT_PWM; eDP1_HPD/DSI1_TE; I2C_LCD_CK; DDC; PU 2K2; I2C_LCD_DAT
part F text: Pin; Net; Type; DP0_LANE0+; Output DP; DP0_LANE0-; DP0_LANE1+; DP0_LANE1-; DP0_LANE2+; DP0_LANE2-; DP0_LANE3+; DP0_LANE3-; DP0_AUX+; PD 100K; I/O DP; DP0_AUX-; PU 100K; DP0_AUX_SEL; PD 1M; CMOS 1.8V; DP0_HPD
part G text: Pin; Net; Type; I2S0_LRCK; I2S0_SDOUT; I2S0_SDIN; CMOS 1.8V; I2S0_CK; AUDIO_MCK; HDA_SYNC/I2S2_LRCK; HDA_SDO/I2S2_SDOUT; HDA_SDI/I2S2_SDIN; or; CMOS 1.5V; HDA_CK/I2S2_CK; GPIO4/HDA_RST#
part H text: Pin; Net; Type; I2C_GP_CK; PU 2K2; CMOS 1.8V; I2C_GP_DAT
part I text: Pin; Net; Type; SER0_TX; SER0_RX; PU 100K; CMOS 1.8V; SER0_RTS#; SER0_CTS#; SER1_TX; SER1_RX; SER2_TX; SER2_RX; SER2_RTS#; SER2_CTS#; SER3_TX; SER3_RX
part J text: Pin; Net; Type; CAN0_TX; CAN0_RX; CMOS 1.8V; CAN1_TX; CAN1_RX
part K text: Pin; Net; Type; USB0+; I/O USB; USB0-; USB0_EN_OC#; PU 10K; CMOS 3.3V; USB0_VBUS_DET; VBUS 5.0V; USB0_OTG_ID; USB1+; USB1-; USB1_EN_OC#; USB2+; USB2-; USB2_SSRX+; USB SS; USB2_SSRX-; USB2_SSTX+; USB2_SSTX-; USB2_EN_OC#; USB3+; USB3-; USB3_SSRX+; USB3_SSRX-; USB3_SSTX+; USB3_SSTX-; USB3_EN_OC#; USB3_VBUS_DET; USB3_OTG_ID; USB4+; USB4-; USB4_EN_OC#; USB5+; USB5-; USB5_EN_OC#
part L text: Pin; Net; Type; PCIE_A_TX+; O PCIE; PCIE_A_TX-; PCIE_A_RX+; I PCIE; PCIE_A_RX-; PCIE_A_REFCK+; PCIE_A_REFCK-; PCIE_A_RST#; CMOS 3.3V; PCIE_A_CKREQ#; PU >10K; PCIE_B_TX+; PCIE_B_TX-; PCIE_B_RX+; PCIE_B_RX-; PCIE_B_REFCK+; PCIE_B_REFCK-; PCIE_B_RST#; PCIE_B_CKREQ#; PCIE_C_TX+/SERDES_1_TX+; PCIE_C_TX-/SERDES_1_TX-; PCIE_C_RX+/SERDES_1_RX+; PCIE_C_RX-/SERDES_1_RX-; PCIE_C_REFCK+; PCIE_C_REFCK-; PCIE_C_RST#; PCIE_D_TX+/SERDES_0_TX+; PCIE_D_TX-/SERDES_0_TX-; PCIE_D_RX+/SERDES_0_RX+; PCIE_D_RX-/SERDES_0_RX-; PCIE_WAKE#; PU 10K; MDIO_CLK; CMOS 1.8V; MDIO_DAT; PU 1K5
part M text: Pin; Net; Type; SATA_TX+; O SATA; SATA_TX-; SATA_RX+; I SATA; SATA_RX-; SATA_ACT#; CMOS 3.3V
part N text: Pin; Net; Type; GBE0_MDI0+; GBE MDI; GBE0_MDI0-; GBE0_MDI1+; GBE0_MDI1-; GBE0_MDI2+; GBE0_MDI2-; GBE0_MDI3+; GBE0_MDI3-; GBE0_LINK100#; CMOS 3.3V; GBE0_LINK1000#; GBE0_LINK_ACT#; GBE0_CTREF; 0V to 3.3V; GBE0_SDP; GBE1_MDI0+; GBE1_MDI0-; GBE1_MDI1+; GBE1_MDI1-; GBE1_MDI2+; GBE1_MDI2-; GBE1_MDI3+; GBE1_MDI3-; GBE1_LINK100#; GBE1_LINK1000#; GBE1_LINK_ACT#; GBE1_CTREF; GBE1_SDP
part O text: Pin; Net; Type; GPIO5/PWM_OUT; PU 470K; GPIO6/TACHIN; GPIO7; GPIO8; GPIO9; CMOS 1.8V; GPIO10; GPIO11; GPIO12; GPIO13
part P text: Pin; Net; Type; WDT_TIME_OUT#; CMOS 1.8V; BATLOW#; PU 10K; CMOS 1.8 - 5.0V; CARRIER_PWR_ON; CARRIER_STBY#; CHARGER_PRSNT#; CHARGING#; VIN_PWR_BAD#; VDD_IN; SLEEP#; LID#; POWER_BTN#; RESET_OUT#; RESET_IN#; I2C_PM_DAT; PU 2K2; I2C_PM_CK; SMB_ALERT#; TEST#; PU vendor specific value; RSVD
part Q text: Pin; Net; Type; BOOT_SEL0#; PU 10K; BOOT_SEL1#; CMOS 1.8V; BOOT_SEL2#; FORCE_RECOV#
part R text: Pin; Net; Type; VDD_IN; Power; Supply; 3.0 - 5.25V; GND; Ground; VDD_RTC; 2.0 - 3.25V

## TC2030-MCP-NL
designator XS?  (no BOM)
Tag connect TC2030-MCP-NL; Value: TC2030-MCP-NL; Mounting: NONE
footprint TC2030-MCP-NL
pins: 1, 2, 3, 4, 5, 6

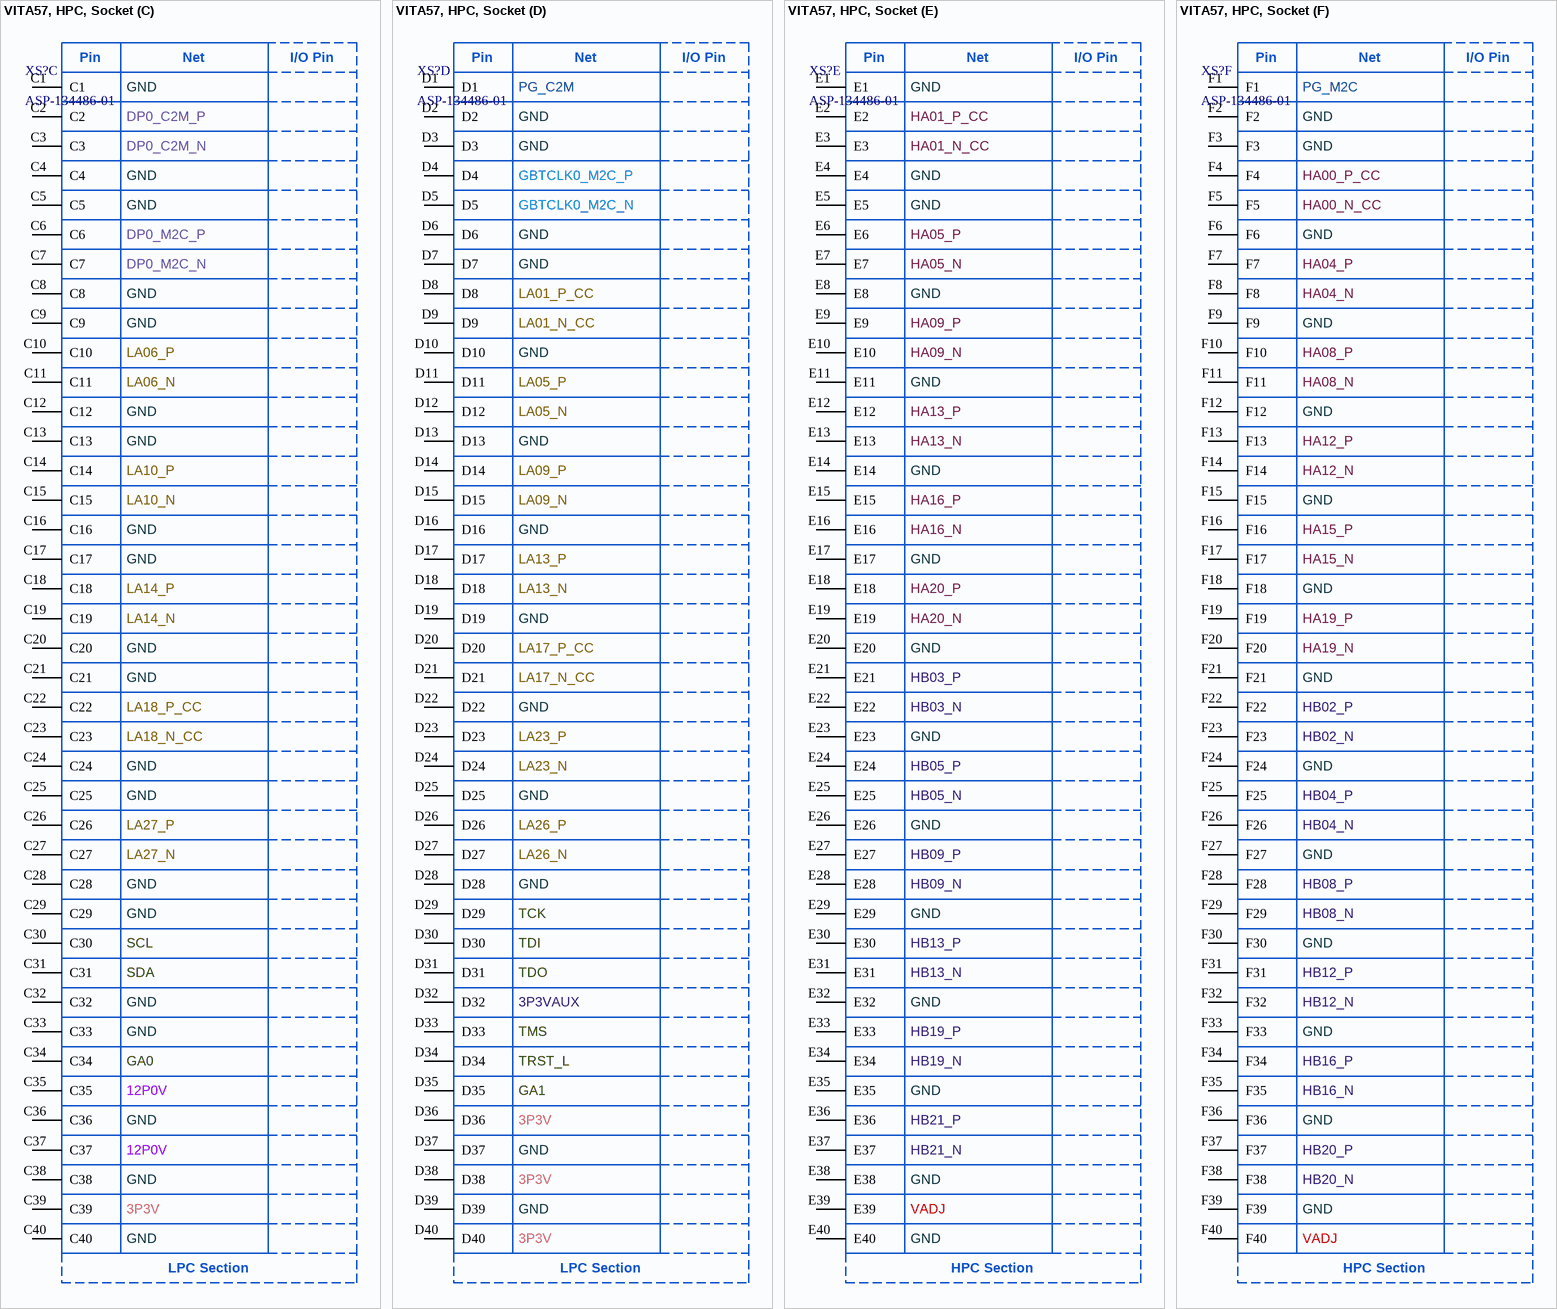
[diagram p16: symbol VITA57, HPC, Socket]

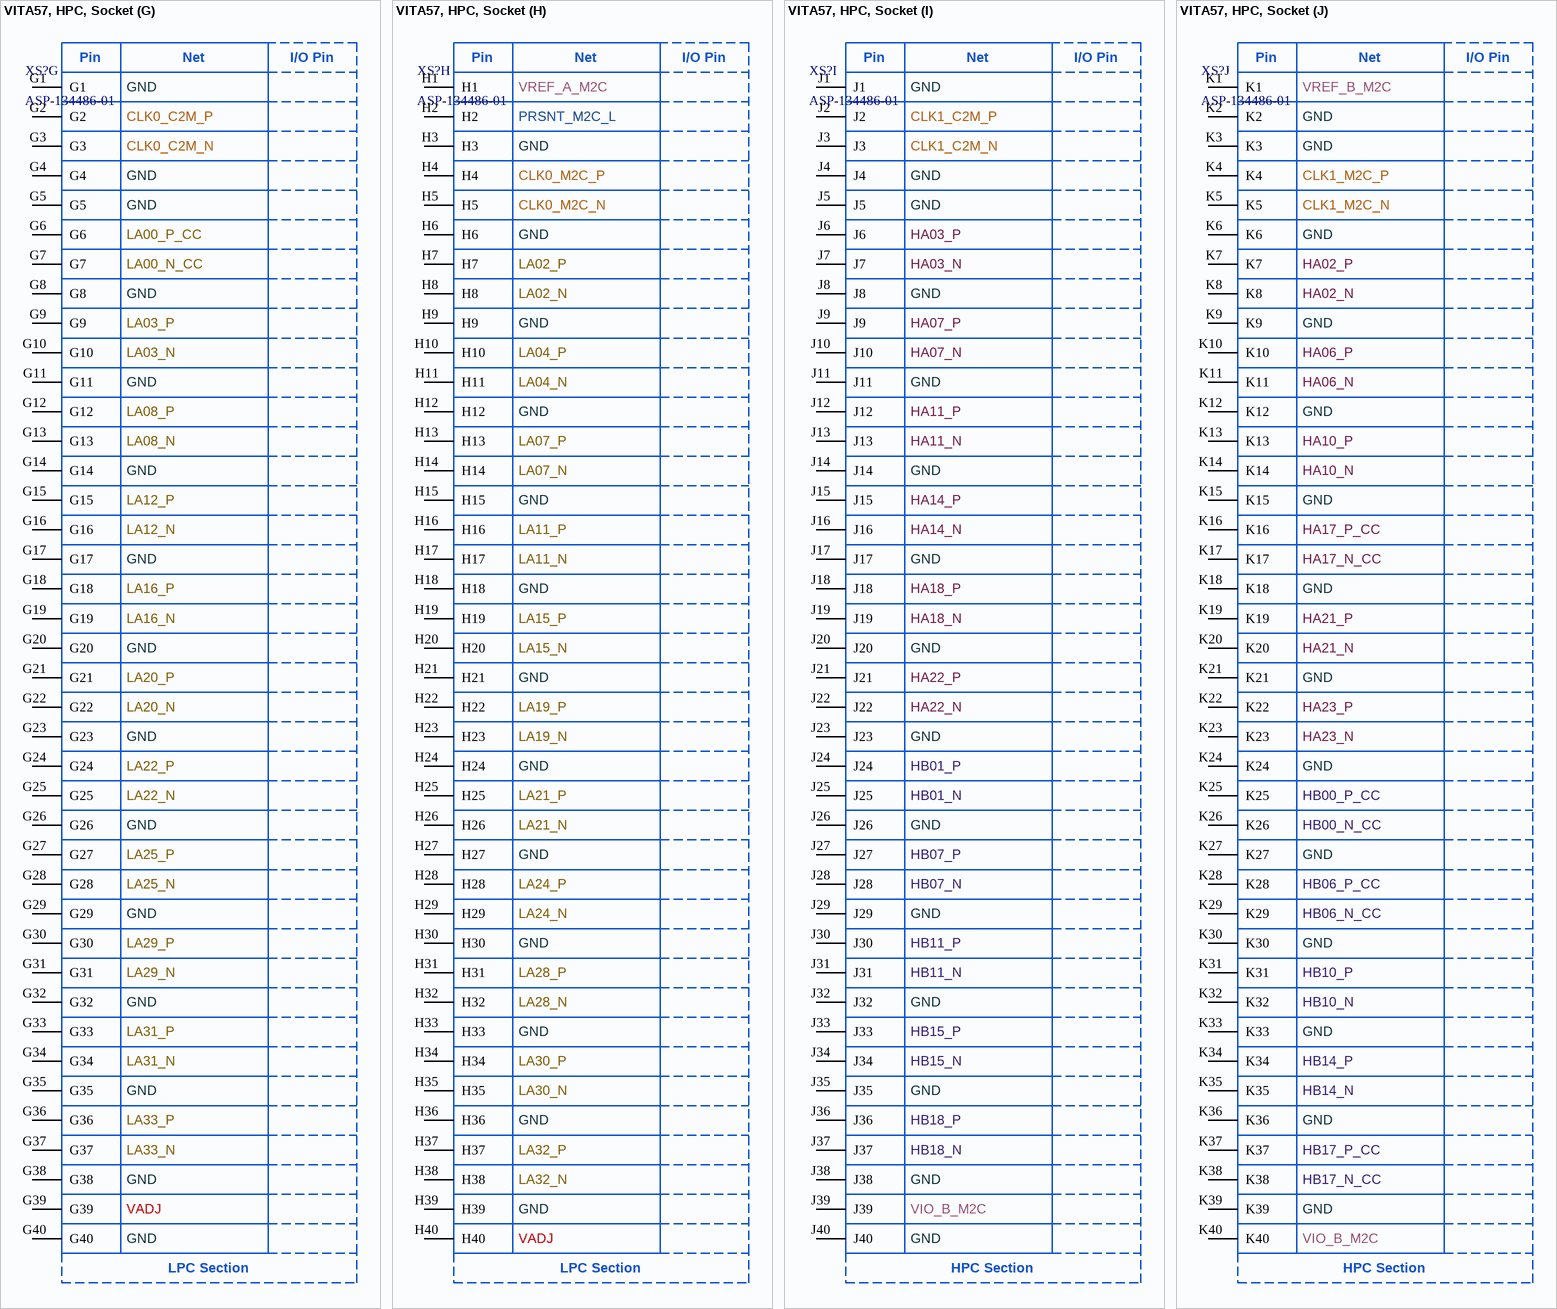
[diagram p17: symbol VITA57, HPC, Socket]

## VITA57, HPC, Socket
designator XS?, comment ASP-134486-01
400 Position Connector Array, Female Sockets Surface Mount Gold; Manufacturer: Samtec; ItemSubType: VITA57; PartNumber: ASP-134486-01; ItemType: Connector; Mounting: SMD
footprint ASP-134486-01 (VITA57 FMC Connector, HPC)
part A pins: A1, A2, A3, A4, A5, A6, A7, A8, A9, A10, A11, A12, A13, A14, A15, A16, A17, A18, A19, A20, A21, A22, A23, A24, A25, A26, A27, A28, A29, A30, A31, A32, A33, A34, A35, A36, A37, A38, A39, A40
part B pins: B1, B2, B3, B4, B5, B6, B7, B8, B9, B10, B11, B12, B13, B14, B15, B16, B17, B18, B19, B20, B21, B22, B23, B24, B25, B26, B27, B28, B29, B30, B31, B32, B33, B34, B35, B36, B37, B38, B39, B40
part C pins: C1, C2, C3, C4, C5, C6, C7, C8, C9, C10, C11, C12, C13, C14, C15, C16, C17, C18, C19, C20, C21, C22, C23, C24, C25, C26, C27, C28, C29, C30, C31, C32, C33, C34, C35, C36, C37, C38, C39, C40
part D pins: D1, D2, D3, D4, D5, D6, D7, D8, D9, D10, D11, D12, D13, D14, D15, D16, D17, D18, D19, D20, D21, D22, D23, D24, D25, D26, D27, D28, D29, D30, D31, D32, D33, D34, D35, D36, D37, D38, D39, D40
part E pins: E1, E2, E3, E4, E5, E6, E7, E8, E9, E10, E11, E12, E13, E14, E15, E16, E17, E18, E19, E20, E21, E22, E23, E24, E25, E26, E27, E28, E29, E30, E31, E32, E33, E34, E35, E36, E37, E38, E39, E40
part F pins: F1, F2, F3, F4, F5, F6, F7, F8, F9, F10, F11, F12, F13, F14, F15, F16, F17, F18, F19, F20, F21, F22, F23, F24, F25, F26, F27, F28, F29, F30, F31, F32, F33, F34, F35, F36, F37, F38, F39, F40
part G pins: G1, G2, G3, G4, G5, G6, G7, G8, G9, G10, G11, G12, G13, G14, G15, G16, G17, G18, G19, G20, G21, G22, G23, G24, G25, G26, G27, G28, G29, G30, G31, G32, G33, G34, G35, G36, G37, G38, G39, G40
part H pins: H1, H2, H3, H4, H5, H6, H7, H8, H9, H10, H11, H12, H13, H14, H15, H16, H17, H18, H19, H20, H21, H22, H23, H24, H25, H26, H27, H28, H29, H30, H31, H32, H33, H34, H35, H36, H37, H38, H39, H40
part I pins: J1, J2, J3, J4, J5, J6, J7, J8, J9, J10, J11, J12, J13, J14, J15, J16, J17, J18, J19, J20, J21, J22, J23, J24, J25, J26, J27, J28, J29, J30, J31, J32, J33, J34, J35, J36, J37, J38, J39, J40
part J pins: K1, K2, K3, K4, K5, K6, K7, K8, K9, K10, K11, K12, K13, K14, K15, K16, K17, K18, K19, K20, K21, K22, K23, K24, K25, K26, K27, K28, K29, K30, K31, K32, K33, K34, K35, K36, K37, K38, K39, K40
part A text: Pin; VITA 57 Name; I/O Pin; GND; DP1_M2C_P; DP1_M2C_N; DP2_M2C_P; DP2_M2C_N; DP3_M2C_P; DP3_M2C_N; DP4_M2C_P; DP4_M2C_N; DP5_M2C_P; DP5_M2C_N; DP1_C2M_P; DP1_C2M_N; DP2_C2M_P; DP2_C2M_N; DP3_C2M_P; DP3_C2M_N; DP4_C2M_P; DP4_C2M_N; DP5_C2M_P; DP5_C2M_N; HPC Section
part B text: Pin; Net; I/O Pin; RES1; GND; DP9_M2C_P; DP9_M2C_N; DP8_M2C_P; DP8_M2C_N; DP7_M2C_P; DP7_M2C_N; DP6_M2C_P; DP6_M2C_N; GBTCLK1_M2C_P; GBTCLK1_M2C_N; DP9_C2M_P; DP9_C2M_N; DP8_C2M_P; DP8_C2M_N; DP7_C2M_P; DP7_C2M_N; DP6_C2M_P; DP6_C2M_N; RES0; HPC Section
part C text: Pin; Net; I/O Pin; GND; DP0_C2M_P; DP0_C2M_N; DP0_M2C_P; DP0_M2C_N; LA06_P; LA06_N; LA10_P; LA10_N; LA14_P; LA14_N; LA18_P_CC; LA18_N_CC; LA27_P; LA27_N; SCL; SDA; GA0; 12P0V; 3P3V; LPC Section
part D text: Pin; Net; I/O Pin; PG_C2M; GND; GBTCLK0_M2C_P; GBTCLK0_M2C_N; LA01_P_CC; LA01_N_CC; LA05_P; LA05_N; LA09_P; LA09_N; LA13_P; LA13_N; LA17_P_CC; LA17_N_CC; LA23_P; LA23_N; LA26_P; LA26_N; TCK; TDI; TDO; 3P3VAUX; TMS; TRST_L; GA1; 3P3V; LPC Section
part E text: Pin; Net; I/O Pin; GND; HA01_P_CC; HA01_N_CC; HA05_P; HA05_N; HA09_P; HA09_N; HA13_P; HA13_N; HA16_P; HA16_N; HA20_P; HA20_N; HB03_P; HB03_N; HB05_P; HB05_N; HB09_P; HB09_N; HB13_P; HB13_N; HB19_P; HB19_N; HB21_P; HB21_N; VADJ; HPC Section
part F text: Pin; Net; I/O Pin; PG_M2C; GND; HA00_P_CC; HA00_N_CC; HA04_P; HA04_N; HA08_P; HA08_N; HA12_P; HA12_N; HA15_P; HA15_N; HA19_P; HA19_N; HB02_P; HB02_N; HB04_P; HB04_N; HB08_P; HB08_N; HB12_P; HB12_N; HB16_P; HB16_N; HB20_P; HB20_N; VADJ; HPC Section
part G text: Pin; Net; I/O Pin; GND; CLK0_C2M_P; CLK0_C2M_N; LA00_P_CC; LA00_N_CC; LA03_P; LA03_N; LA08_P; LA08_N; LA12_P; LA12_N; LA16_P; LA16_N; LA20_P; LA20_N; LA22_P; LA22_N; LA25_P; LA25_N; LA29_P; LA29_N; LA31_P; LA31_N; LA33_P; LA33_N; VADJ; LPC Section
part H text: Pin; Net; I/O Pin; VREF_A_M2C; PRSNT_M2C_L; GND; CLK0_M2C_P; CLK0_M2C_N; LA02_P; LA02_N; LA04_P; LA04_N; LA07_P; LA07_N; LA11_P; LA11_N; LA15_P; LA15_N; LA19_P; LA19_N; LA21_P; LA21_N; LA24_P; LA24_N; LA28_P; LA28_N; LA30_P; LA30_N; LA32_P; LA32_N; VADJ; LPC Section
part I text: Pin; Net; I/O Pin; GND; CLK1_C2M_P; CLK1_C2M_N; HA03_P; HA03_N; HA07_P; HA07_N; HA11_P; HA11_N; HA14_P; HA14_N; HA18_P; HA18_N; HA22_P; HA22_N; HB01_P; HB01_N; HB07_P; HB07_N; HB11_P; HB11_N; HB15_P; HB15_N; HB18_P; HB18_N; VIO_B_M2C; HPC Section
part J text: Pin; Net; I/O Pin; VREF_B_M2C; GND; CLK1_M2C_P; CLK1_M2C_N; HA02_P; HA02_N; HA06_P; HA06_N; HA10_P; HA10_N; HA17_P_CC; HA17_N_CC; HA21_P; HA21_N; HA23_P; HA23_N; HB00_P_CC; HB00_N_CC; HB06_P_CC; HB06_N_CC; HB10_P; HB10_N; HB14_P; HB14_N; HB17_P_CC; HB17_N_CC; VIO_B_M2C; HPC Section

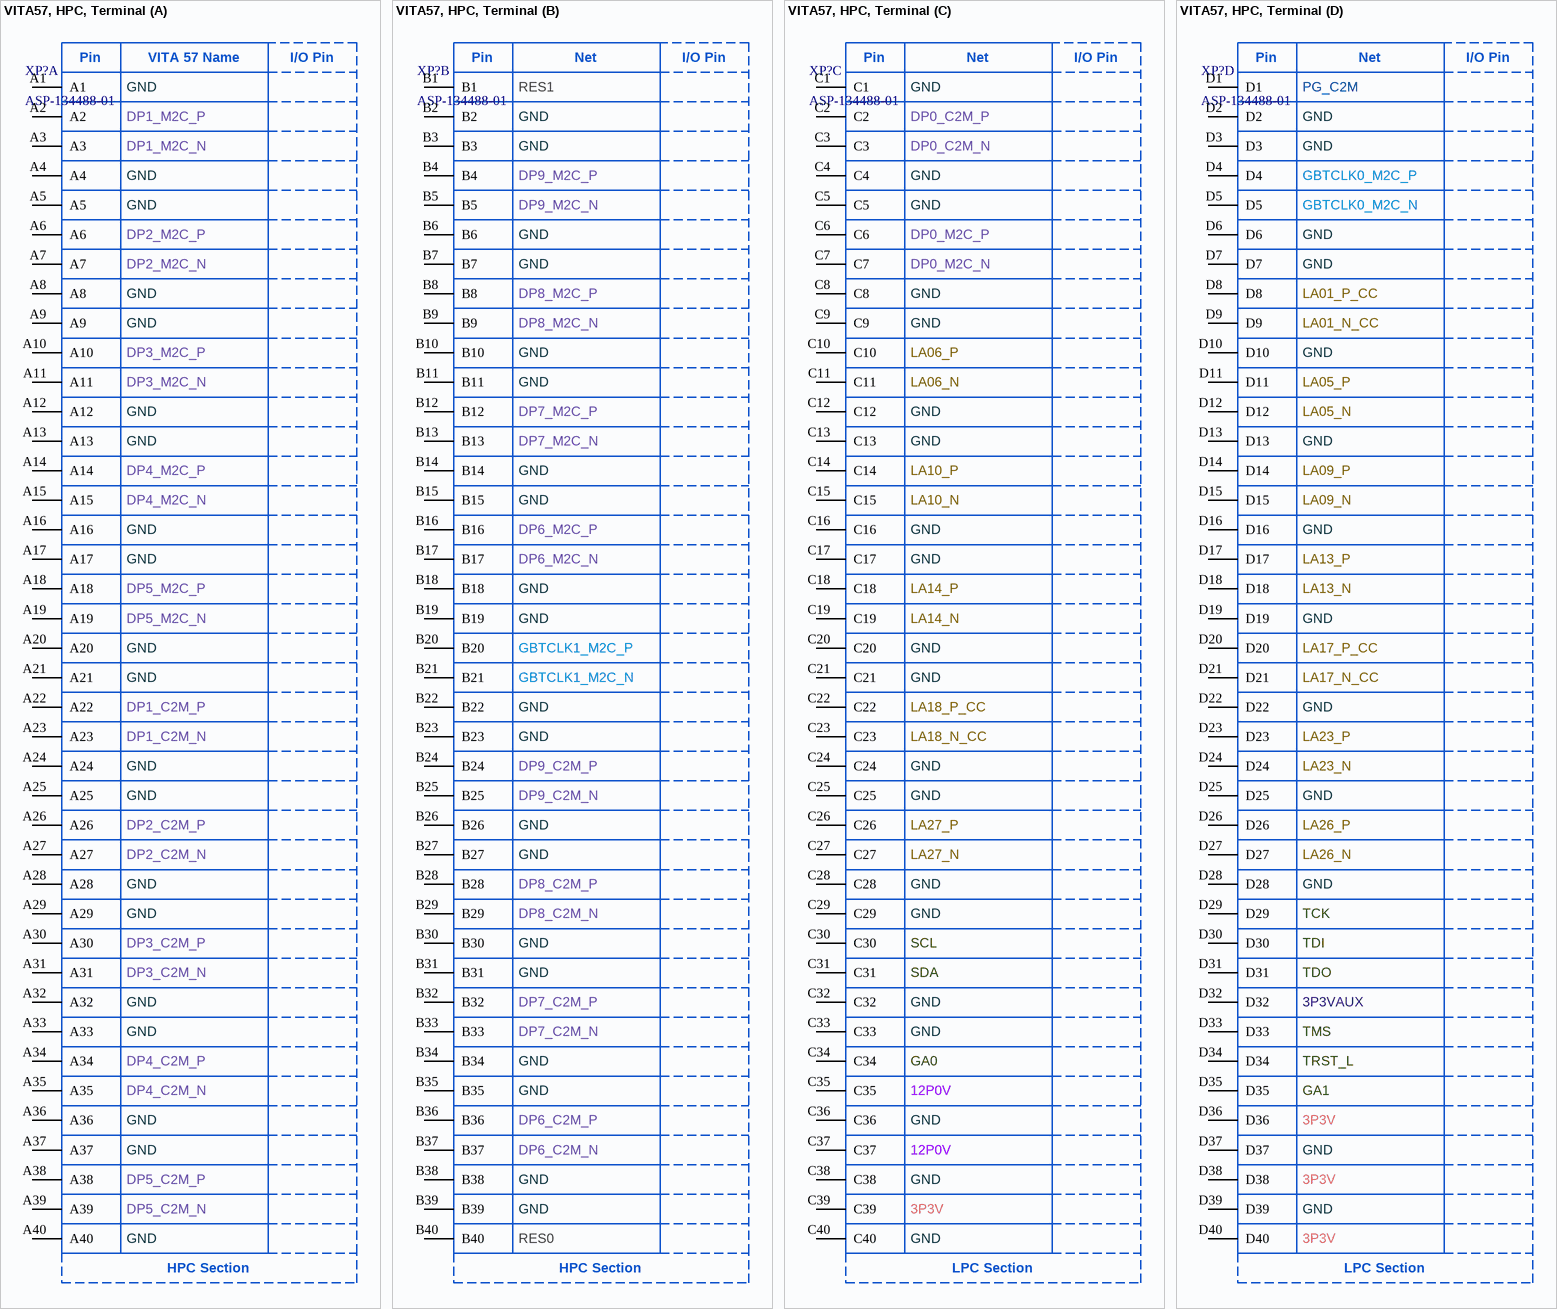
[diagram p18: symbol VITA57, HPC, Terminal]

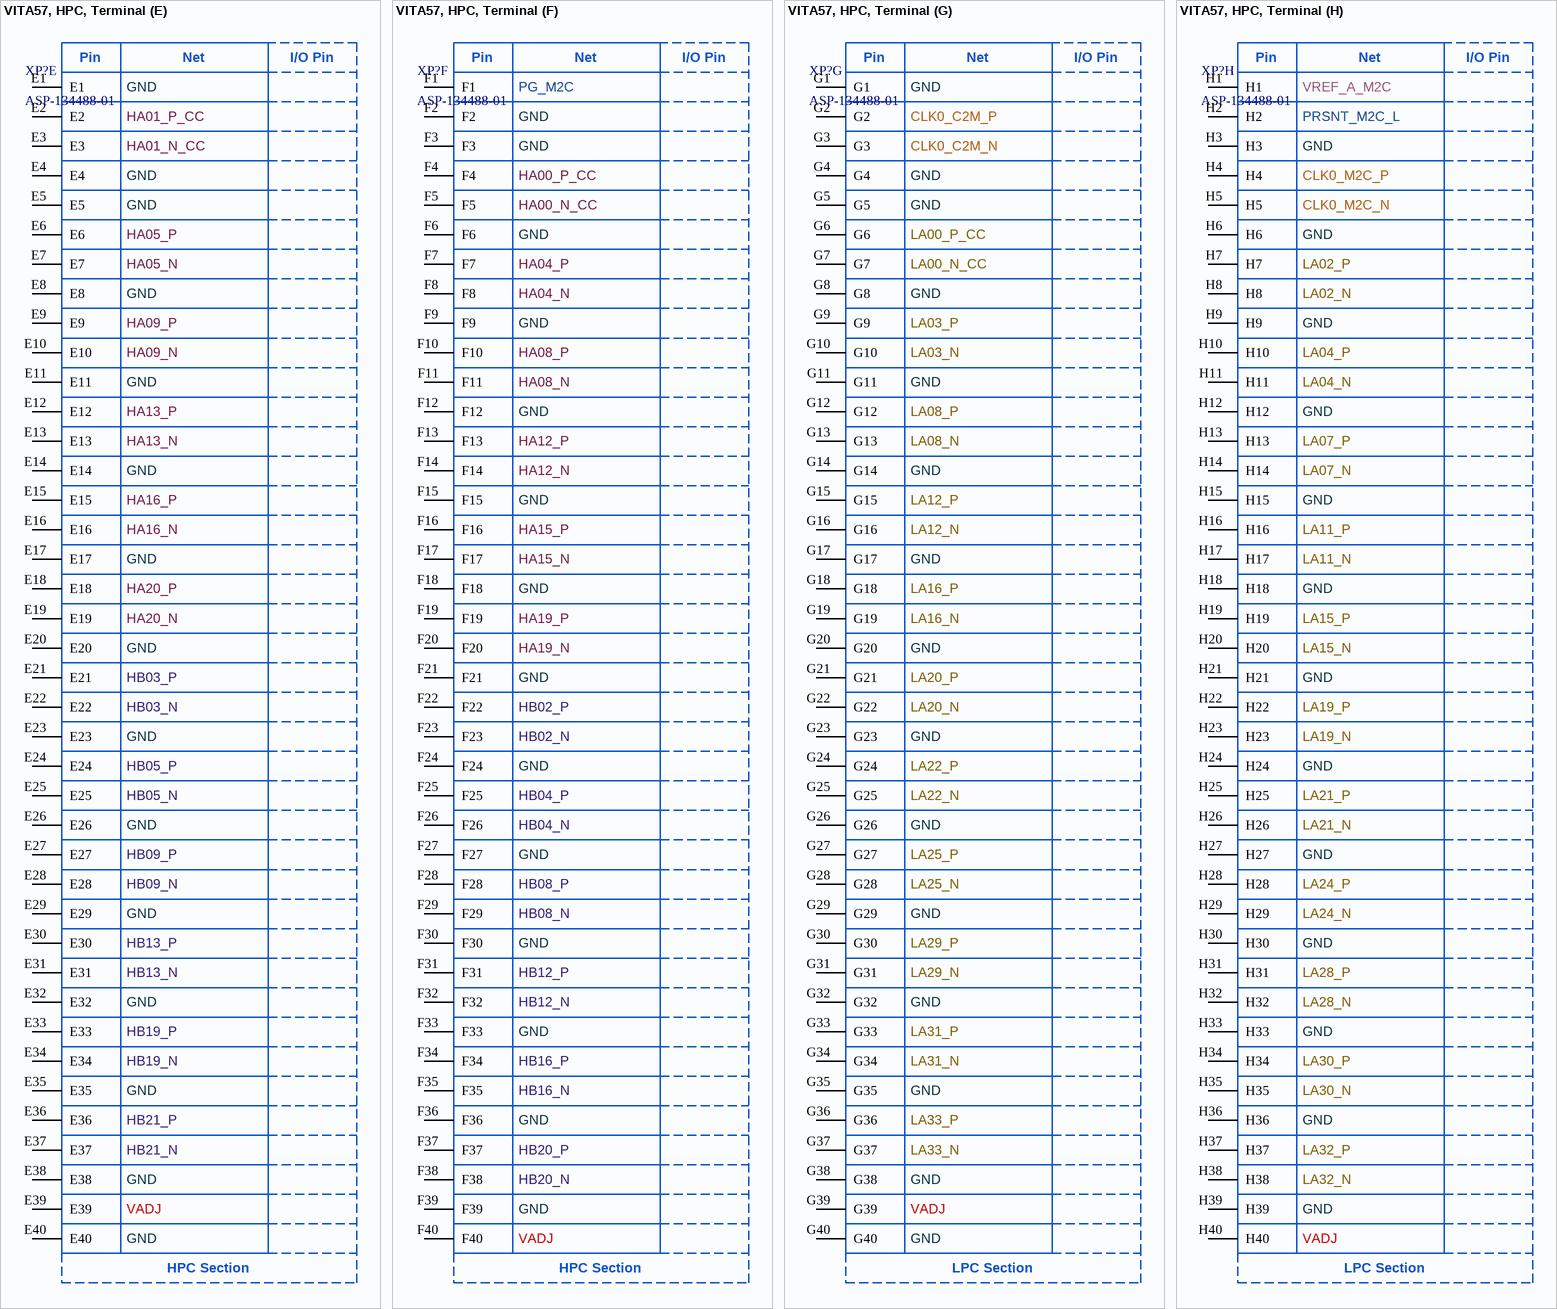
[diagram p19: symbol VITA57, HPC, Terminal]

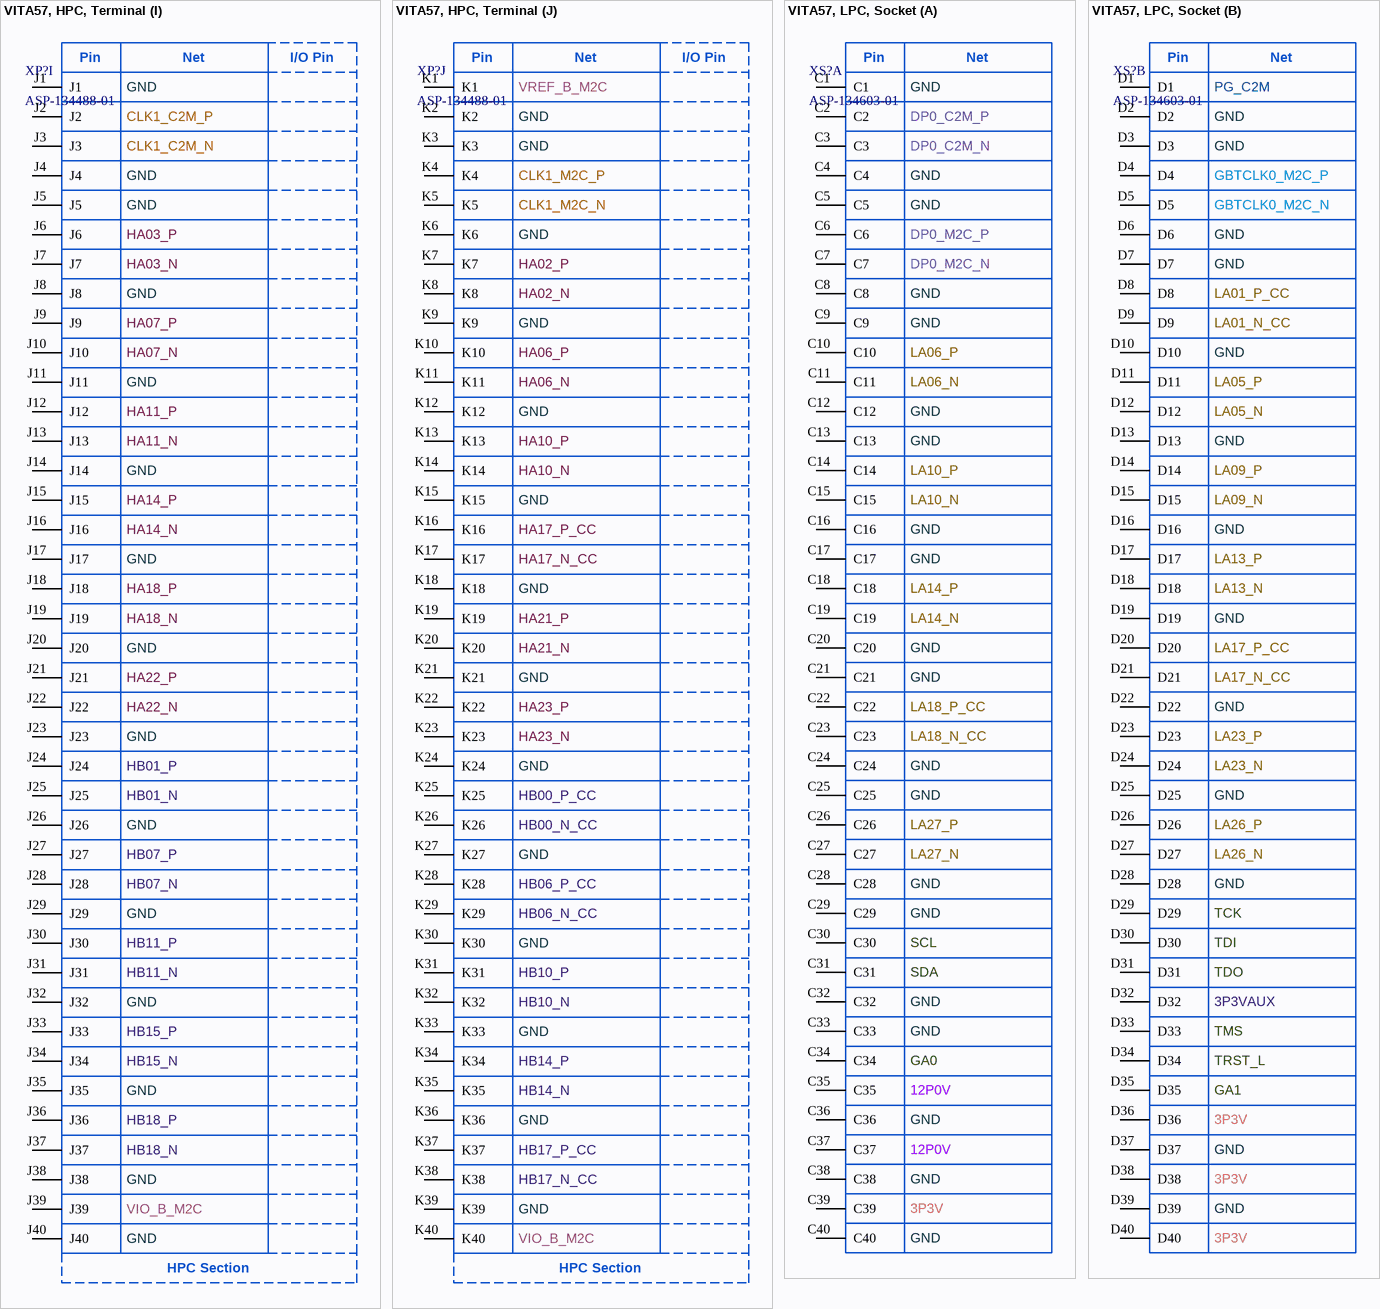
[diagram p20: symbols VITA57, HPC, Terminal to VITA57, LPC, Socket]

## VITA57, HPC, Terminal
designator XP?, comment ASP-134488-01
400 Position Connector Array, Male Terminal Surface Mount Gold; Manufacturer: Samtec; ItemSubType: VITA57; PartNumber: ASP-134488-01; ItemType: Connector; Mounting: SMD
footprint ASP-134488-01 (VITA57 FMC Connector, HPC)
part A pins: A1, A2, A3, A4, A5, A6, A7, A8, A9, A10, A11, A12, A13, A14, A15, A16, A17, A18, A19, A20, A21, A22, A23, A24, A25, A26, A27, A28, A29, A30, A31, A32, A33, A34, A35, A36, A37, A38, A39, A40
part B pins: B1, B2, B3, B4, B5, B6, B7, B8, B9, B10, B11, B12, B13, B14, B15, B16, B17, B18, B19, B20, B21, B22, B23, B24, B25, B26, B27, B28, B29, B30, B31, B32, B33, B34, B35, B36, B37, B38, B39, B40
part C pins: C1, C2, C3, C4, C5, C6, C7, C8, C9, C10, C11, C12, C13, C14, C15, C16, C17, C18, C19, C20, C21, C22, C23, C24, C25, C26, C27, C28, C29, C30, C31, C32, C33, C34, C35, C36, C37, C38, C39, C40
part D pins: D1, D2, D3, D4, D5, D6, D7, D8, D9, D10, D11, D12, D13, D14, D15, D16, D17, D18, D19, D20, D21, D22, D23, D24, D25, D26, D27, D28, D29, D30, D31, D32, D33, D34, D35, D36, D37, D38, D39, D40
part E pins: E1, E2, E3, E4, E5, E6, E7, E8, E9, E10, E11, E12, E13, E14, E15, E16, E17, E18, E19, E20, E21, E22, E23, E24, E25, E26, E27, E28, E29, E30, E31, E32, E33, E34, E35, E36, E37, E38, E39, E40
part F pins: F1, F2, F3, F4, F5, F6, F7, F8, F9, F10, F11, F12, F13, F14, F15, F16, F17, F18, F19, F20, F21, F22, F23, F24, F25, F26, F27, F28, F29, F30, F31, F32, F33, F34, F35, F36, F37, F38, F39, F40
part G pins: G1, G2, G3, G4, G5, G6, G7, G8, G9, G10, G11, G12, G13, G14, G15, G16, G17, G18, G19, G20, G21, G22, G23, G24, G25, G26, G27, G28, G29, G30, G31, G32, G33, G34, G35, G36, G37, G38, G39, G40
part H pins: H1, H2, H3, H4, H5, H6, H7, H8, H9, H10, H11, H12, H13, H14, H15, H16, H17, H18, H19, H20, H21, H22, H23, H24, H25, H26, H27, H28, H29, H30, H31, H32, H33, H34, H35, H36, H37, H38, H39, H40
part I pins: J1, J2, J3, J4, J5, J6, J7, J8, J9, J10, J11, J12, J13, J14, J15, J16, J17, J18, J19, J20, J21, J22, J23, J24, J25, J26, J27, J28, J29, J30, J31, J32, J33, J34, J35, J36, J37, J38, J39, J40
part J pins: K1, K2, K3, K4, K5, K6, K7, K8, K9, K10, K11, K12, K13, K14, K15, K16, K17, K18, K19, K20, K21, K22, K23, K24, K25, K26, K27, K28, K29, K30, K31, K32, K33, K34, K35, K36, K37, K38, K39, K40
part A text: Pin; VITA 57 Name; I/O Pin; GND; DP1_M2C_P; DP1_M2C_N; DP2_M2C_P; DP2_M2C_N; DP3_M2C_P; DP3_M2C_N; DP4_M2C_P; DP4_M2C_N; DP5_M2C_P; DP5_M2C_N; DP1_C2M_P; DP1_C2M_N; DP2_C2M_P; DP2_C2M_N; DP3_C2M_P; DP3_C2M_N; DP4_C2M_P; DP4_C2M_N; DP5_C2M_P; DP5_C2M_N; HPC Section
part B text: Pin; Net; I/O Pin; RES1; GND; DP9_M2C_P; DP9_M2C_N; DP8_M2C_P; DP8_M2C_N; DP7_M2C_P; DP7_M2C_N; DP6_M2C_P; DP6_M2C_N; GBTCLK1_M2C_P; GBTCLK1_M2C_N; DP9_C2M_P; DP9_C2M_N; DP8_C2M_P; DP8_C2M_N; DP7_C2M_P; DP7_C2M_N; DP6_C2M_P; DP6_C2M_N; RES0; HPC Section
part C text: Pin; Net; I/O Pin; GND; DP0_C2M_P; DP0_C2M_N; DP0_M2C_P; DP0_M2C_N; LA06_P; LA06_N; LA10_P; LA10_N; LA14_P; LA14_N; LA18_P_CC; LA18_N_CC; LA27_P; LA27_N; SCL; SDA; GA0; 12P0V; 3P3V; LPC Section
part D text: Pin; Net; I/O Pin; PG_C2M; GND; GBTCLK0_M2C_P; GBTCLK0_M2C_N; LA01_P_CC; LA01_N_CC; LA05_P; LA05_N; LA09_P; LA09_N; LA13_P; LA13_N; LA17_P_CC; LA17_N_CC; LA23_P; LA23_N; LA26_P; LA26_N; TCK; TDI; TDO; 3P3VAUX; TMS; TRST_L; GA1; 3P3V; LPC Section
part E text: Pin; Net; I/O Pin; GND; HA01_P_CC; HA01_N_CC; HA05_P; HA05_N; HA09_P; HA09_N; HA13_P; HA13_N; HA16_P; HA16_N; HA20_P; HA20_N; HB03_P; HB03_N; HB05_P; HB05_N; HB09_P; HB09_N; HB13_P; HB13_N; HB19_P; HB19_N; HB21_P; HB21_N; VADJ; HPC Section
part F text: Pin; Net; I/O Pin; PG_M2C; GND; HA00_P_CC; HA00_N_CC; HA04_P; HA04_N; HA08_P; HA08_N; HA12_P; HA12_N; HA15_P; HA15_N; HA19_P; HA19_N; HB02_P; HB02_N; HB04_P; HB04_N; HB08_P; HB08_N; HB12_P; HB12_N; HB16_P; HB16_N; HB20_P; HB20_N; VADJ; HPC Section
part G text: Pin; Net; I/O Pin; GND; CLK0_C2M_P; CLK0_C2M_N; LA00_P_CC; LA00_N_CC; LA03_P; LA03_N; LA08_P; LA08_N; LA12_P; LA12_N; LA16_P; LA16_N; LA20_P; LA20_N; LA22_P; LA22_N; LA25_P; LA25_N; LA29_P; LA29_N; LA31_P; LA31_N; LA33_P; LA33_N; VADJ; LPC Section
part H text: Pin; Net; I/O Pin; VREF_A_M2C; PRSNT_M2C_L; GND; CLK0_M2C_P; CLK0_M2C_N; LA02_P; LA02_N; LA04_P; LA04_N; LA07_P; LA07_N; LA11_P; LA11_N; LA15_P; LA15_N; LA19_P; LA19_N; LA21_P; LA21_N; LA24_P; LA24_N; LA28_P; LA28_N; LA30_P; LA30_N; LA32_P; LA32_N; VADJ; LPC Section
part I text: Pin; Net; I/O Pin; GND; CLK1_C2M_P; CLK1_C2M_N; HA03_P; HA03_N; HA07_P; HA07_N; HA11_P; HA11_N; HA14_P; HA14_N; HA18_P; HA18_N; HA22_P; HA22_N; HB01_P; HB01_N; HB07_P; HB07_N; HB11_P; HB11_N; HB15_P; HB15_N; HB18_P; HB18_N; VIO_B_M2C; HPC Section
part J text: Pin; Net; I/O Pin; VREF_B_M2C; GND; CLK1_M2C_P; CLK1_M2C_N; HA02_P; HA02_N; HA06_P; HA06_N; HA10_P; HA10_N; HA17_P_CC; HA17_N_CC; HA21_P; HA21_N; HA23_P; HA23_N; HB00_P_CC; HB00_N_CC; HB06_P_CC; HB06_N_CC; HB10_P; HB10_N; HB14_P; HB14_N; HB17_P_CC; HB17_N_CC; VIO_B_M2C; HPC Section

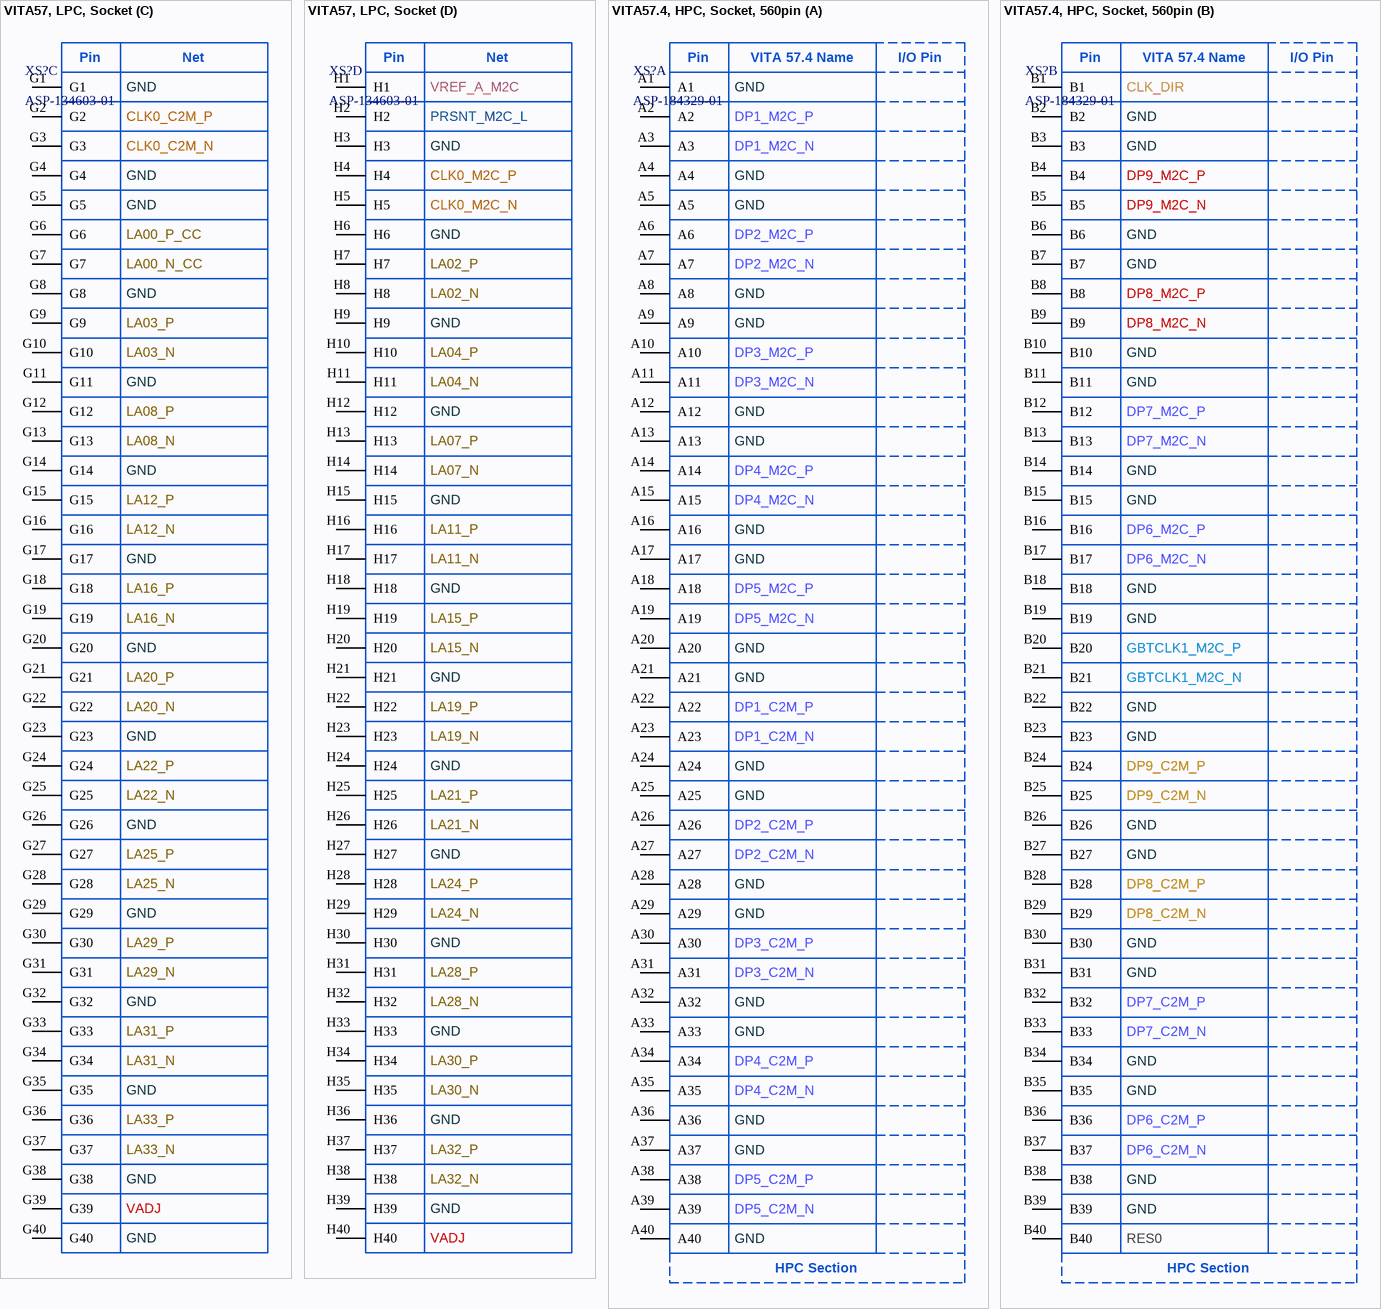
[diagram p21: symbols VITA57, LPC, Socket to VITA57.4, HPC, Socket, 560pin]

## VITA57, LPC, Socket
designator XS?, comment ASP-134603-01
160 Position Connector Array, Female Sockets Surface Mount Gold; Manufacturer: Samtec; ItemSubType: VITA57; PartNumber: ASP-134603-01; ItemType: Connector; Mounting: SMD
footprint ASP-134603-01 (VITA57 FMC Connector, LPC)
part A pins: C1, C2, C3, C4, C5, C6, C7, C8, C9, C10, C11, C12, C13, C14, C15, C16, C17, C18, C19, C20, C21, C22, C23, C24, C25, C26, C27, C28, C29, C30, C31, C32, C33, C34, C35, C36, C37, C38, C39, C40
part B pins: D1, D2, D3, D4, D5, D6, D7, D8, D9, D10, D11, D12, D13, D14, D15, D16, D17, D18, D19, D20, D21, D22, D23, D24, D25, D26, D27, D28, D29, D30, D31, D32, D33, D34, D35, D36, D37, D38, D39, D40
part C pins: G1, G2, G3, G4, G5, G6, G7, G8, G9, G10, G11, G12, G13, G14, G15, G16, G17, G18, G19, G20, G21, G22, G23, G24, G25, G26, G27, G28, G29, G30, G31, G32, G33, G34, G35, G36, G37, G38, G39, G40
part D pins: H1, H2, H3, H4, H5, H6, H7, H8, H9, H10, H11, H12, H13, H14, H15, H16, H17, H18, H19, H20, H21, H22, H23, H24, H25, H26, H27, H28, H29, H30, H31, H32, H33, H34, H35, H36, H37, H38, H39, H40
part A text: Pin; Net; GND; DP0_C2M_P; DP0_C2M_N; DP0_M2C_P; DP0_M2C_N; LA06_P; LA06_N; LA10_P; LA10_N; LA14_P; LA14_N; LA18_P_CC; LA18_N_CC; LA27_P; LA27_N; SCL; SDA; GA0; 12P0V; 3P3V
part B text: Pin; Net; PG_C2M; GND; GBTCLK0_M2C_P; GBTCLK0_M2C_N; LA01_P_CC; LA01_N_CC; LA05_P; LA05_N; LA09_P; LA09_N; LA13_P; LA13_N; LA17_P_CC; LA17_N_CC; LA23_P; LA23_N; LA26_P; LA26_N; TCK; TDI; TDO; 3P3VAUX; TMS; TRST_L; GA1; 3P3V
part C text: Pin; Net; GND; CLK0_C2M_P; CLK0_C2M_N; LA00_P_CC; LA00_N_CC; LA03_P; LA03_N; LA08_P; LA08_N; LA12_P; LA12_N; LA16_P; LA16_N; LA20_P; LA20_N; LA22_P; LA22_N; LA25_P; LA25_N; LA29_P; LA29_N; LA31_P; LA31_N; LA33_P; LA33_N; VADJ
part D text: Pin; Net; VREF_A_M2C; PRSNT_M2C_L; GND; CLK0_M2C_P; CLK0_M2C_N; LA02_P; LA02_N; LA04_P; LA04_N; LA07_P; LA07_N; LA11_P; LA11_N; LA15_P; LA15_N; LA19_P; LA19_N; LA21_P; LA21_N; LA24_P; LA24_N; LA28_P; LA28_N; LA30_P; LA30_N; LA32_P; LA32_N; VADJ

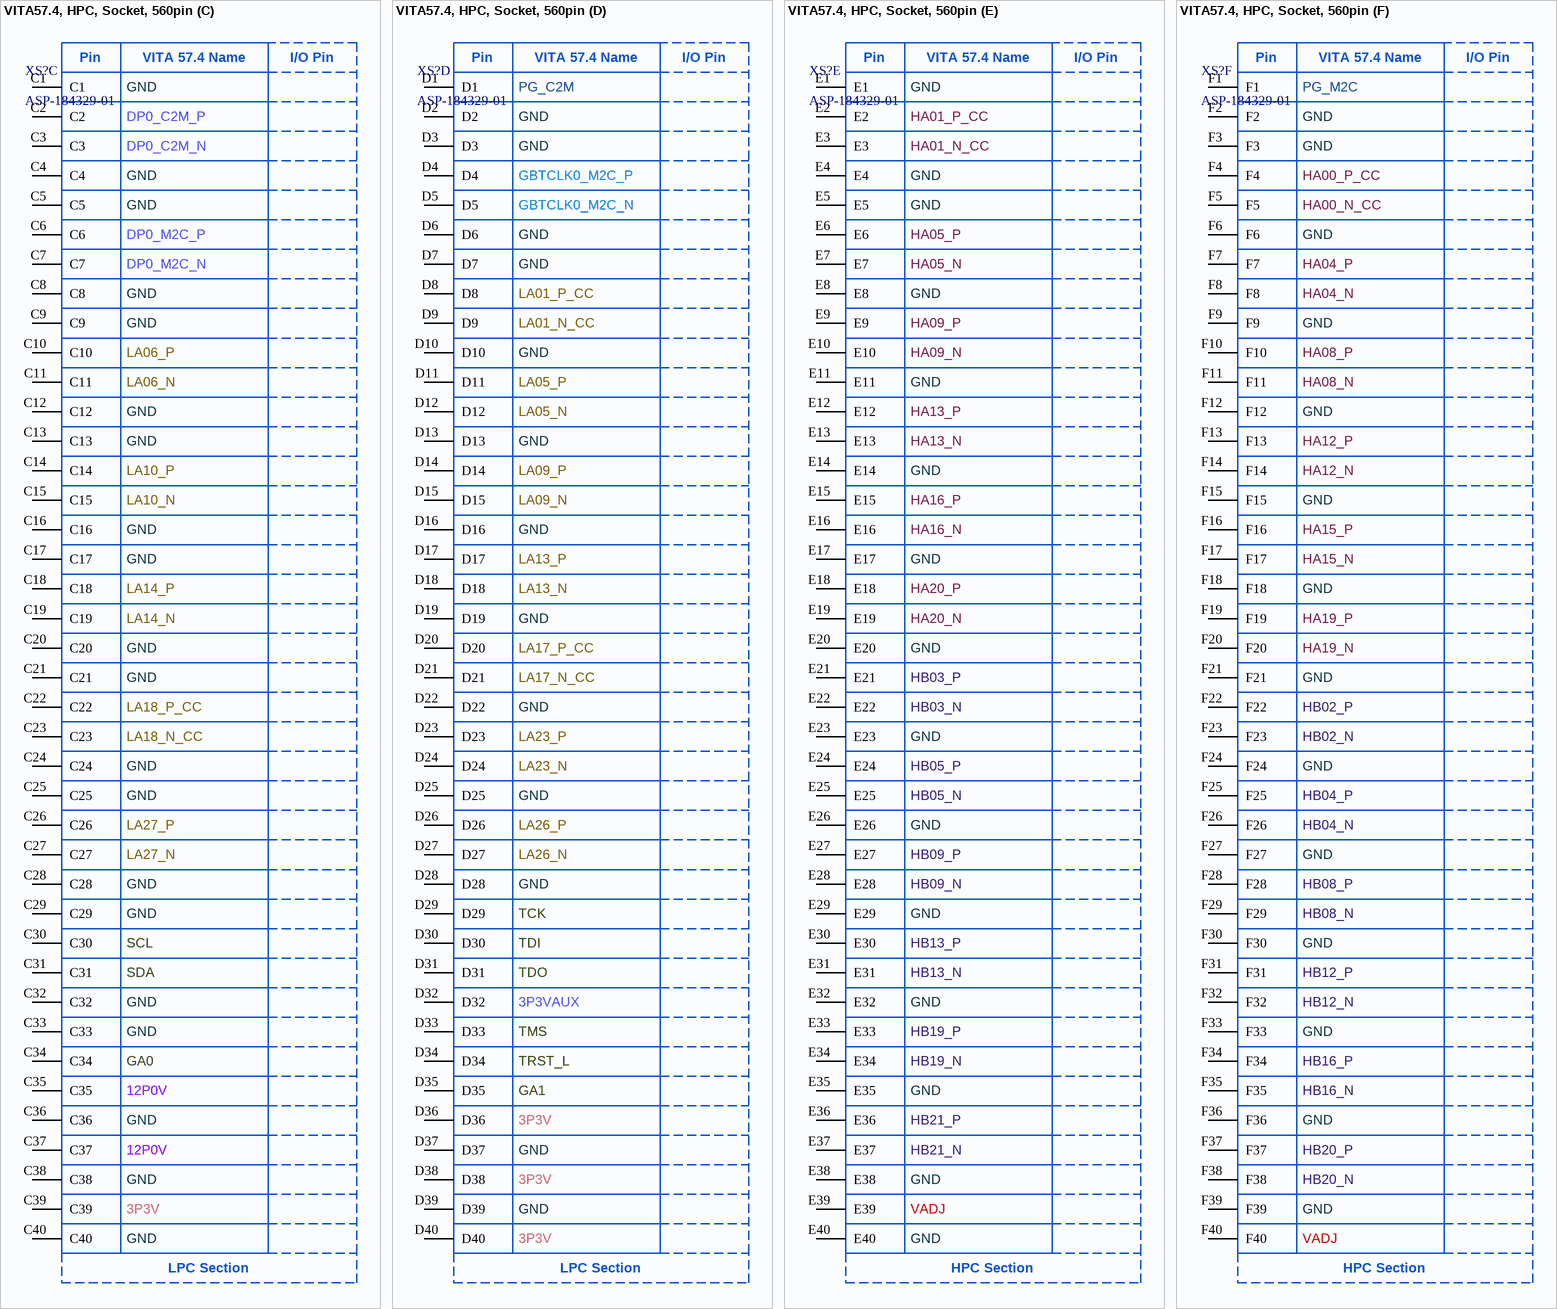
[diagram p22: symbol VITA57.4, HPC, Socket, 560pin]